# Altium integrated library CDE_Library.IntLib: 6171 symbols (part 16 of 25)
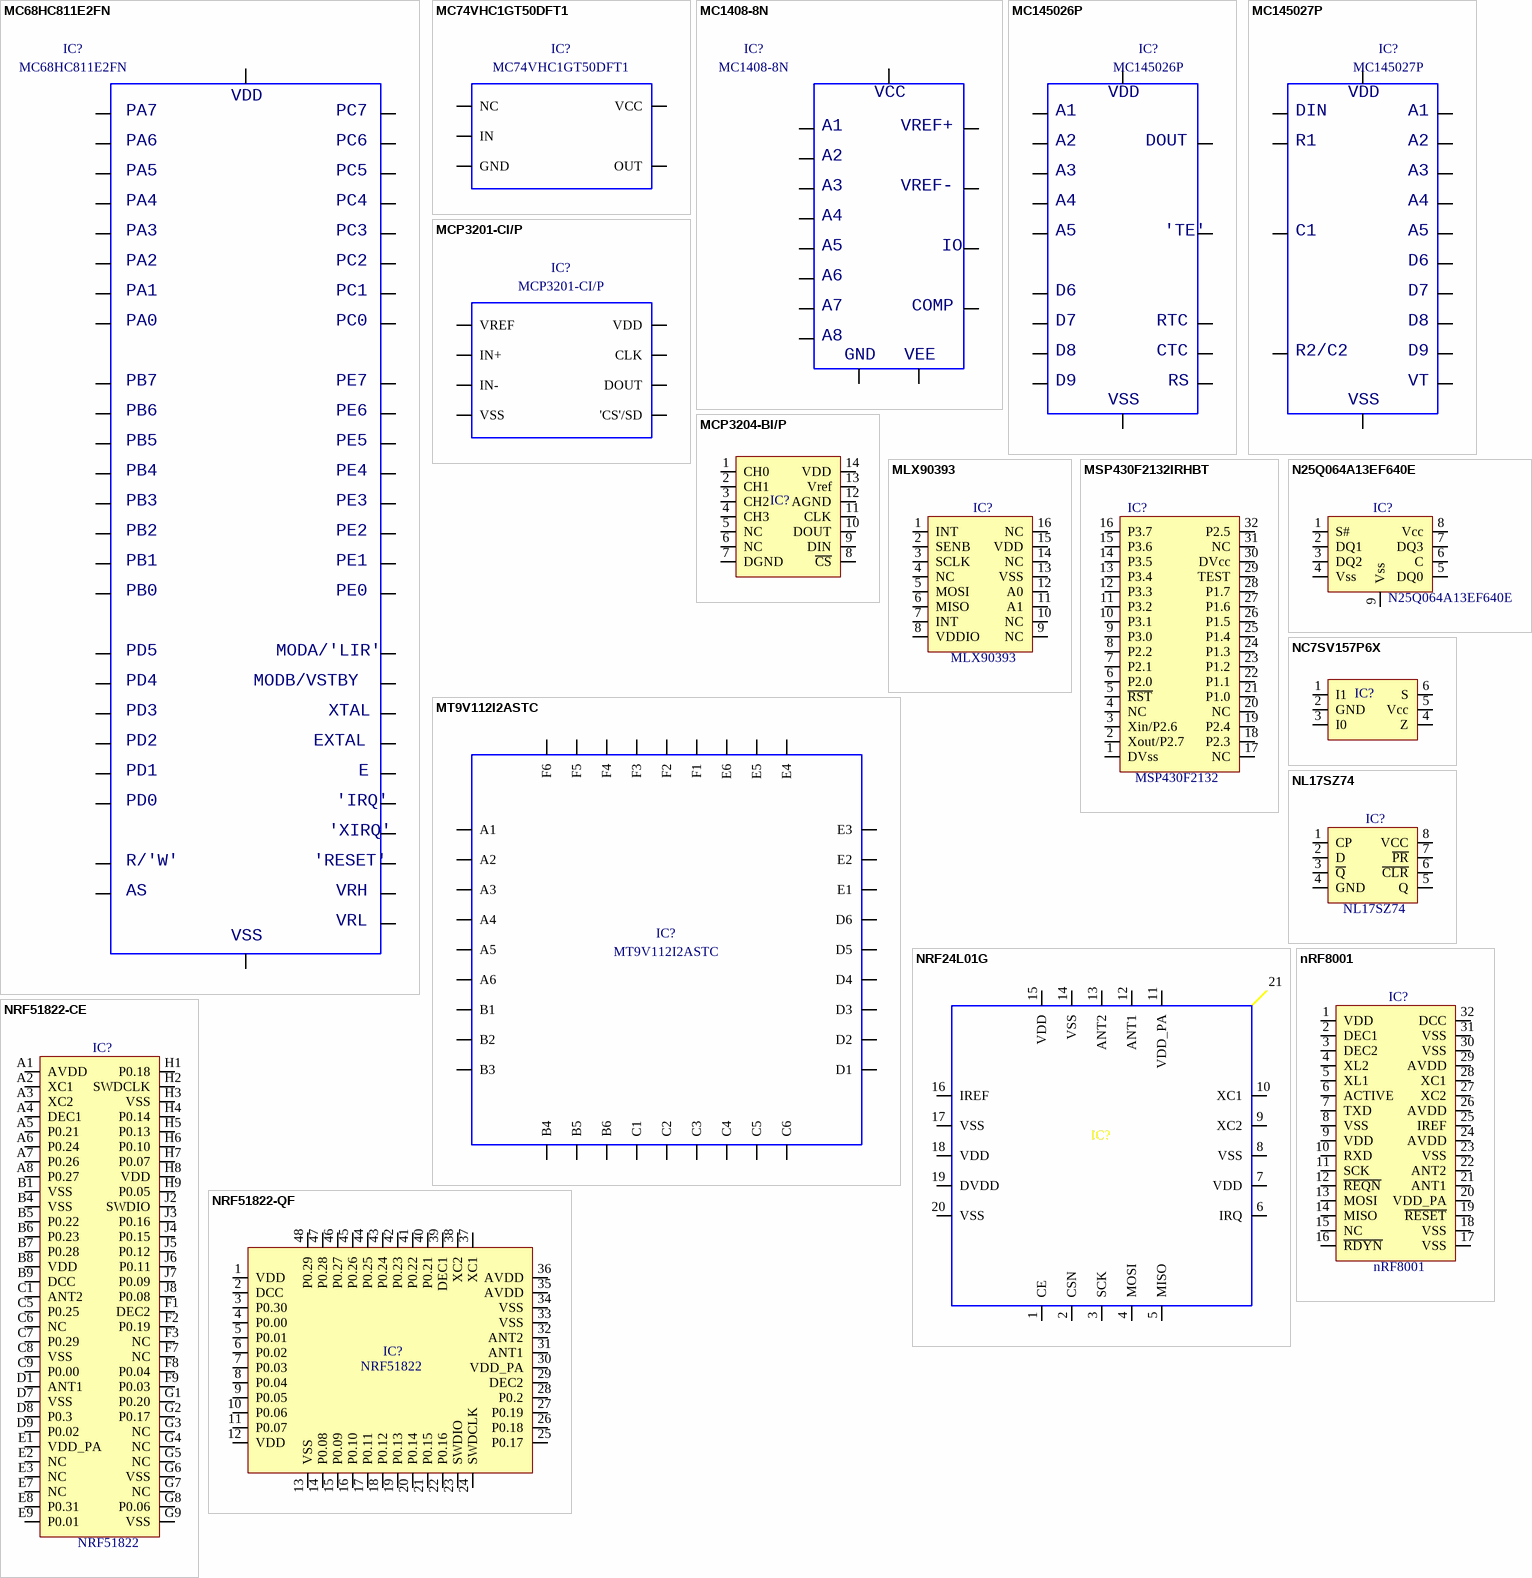
[diagram p272: symbols MC68HC811E2FN to NRF51822-QF]

## nRF8001
designator IC?
Single-chip Bluetooth low-energy solution
footprint smd QFN/32 (5x5mm pitch 0.5)
pins: 1 VDD, 2 DEC1, 3 DEC2, 4 XL2, 5 XL1, 6 ACTIVE, 7 TXD, 8 VSS, 9 VDD, 10 RXD, 11 SCK, 12 ~{REQN}, 13 MOSI, 14 MISO, 15 NC, 16 ~{RDYN}, 17 VSS, 18 VSS, 19 ~{RESET}, 20 VDD_PA, 21 ANT1, 22 ANT2, 23 VSS, 24 AVDD, 25 IREF, 26 AVDD, 27 XC2, 28 XC1, 29 AVDD, 30 VSS, 31 VSS, 32 DCC

## NRF51822-CE
designator IC?, comment NRF51822
Multiprotocol Bluetooth® 4.0 low energy/2.4 GHz RF SoC
footprint smd WLCSP/9x9
pins: A1 AVDD, A2 XC1, A3 XC2, A4 DEC1, A5 P0.21, A6 P0.24, A7 P0.26, A8 P0.27, B1 VSS, B4 VSS, B5 P0.22, B6 P0.23, B7 P0.28, B8 VDD, B9 DCC, C1 ANT2, C5 P0.25, C6 NC, C7 P0.29, C8 VSS, C9 P0.00, D1 ANT1, D7 VSS, D8 P0.3, D9 P0.02, E1 VDD_PA, E2 NC, E3 NC, E7 NC, E8 P0.31, E9 P0.01, F1 DEC2, F2 P0.19, F3 NC, F7 NC, F8 P0.04, F9 P0.03, G1 P0.20, G2 P0.17, G3 NC, G4 NC, G5 NC, G6 VSS, G7 NC, G8 P0.06, G9 VSS, H1 P0.18, H2 SWDCLK, H3 VSS, H4 P0.14, H5 P0.13, H6 P0.10, H7 P0.07, H8 VDD, H9 P0.05, J2 SWDIO, J3 P0.16, J4 P0.15, J5 P0.12, J6 P0.11, J7 P0.09, J8 P0.08

## NRF51822-QF
designator IC?, comment NRF51822
Multiprotocol Bluetooth® 4.0 low energy/2.4 GHz RF SoC
footprint SMD QFN/48 (6X6MM)
pins: 1 VDD, 2 DCC, 3 P0.30, 4 P0.00, 5 P0.01, 6 P0.02, 7 P0.03, 8 P0.04, 9 P0.05, 10 P0.06, 11 P0.07, 12 VDD, 13 VSS, 14 P0.08, 15 P0.09, 16 P0.10, 17 P0.11, 18 P0.12, 19 P0.13, 20 P0.14, 21 P0.15, 22 P0.16, 23 SWDIO, 24 SWDCLK, 25 P0.17, 26 P0.18, 27 P0.19, 28 P0.2, 29 DEC2, 30 VDD_PA, 31 ANT1, 32 ANT2, 33 VSS, 34 VSS, 35 AVDD, 36 AVDD, 37 XC1, 38 XC2, 39 DEC1, 40 P0.21, 41 P0.22, 42 P0.23, 43 P0.24, 44 P0.25, 45 P0.26, 46 P0.27, 47 P0.28, 48 P0.29

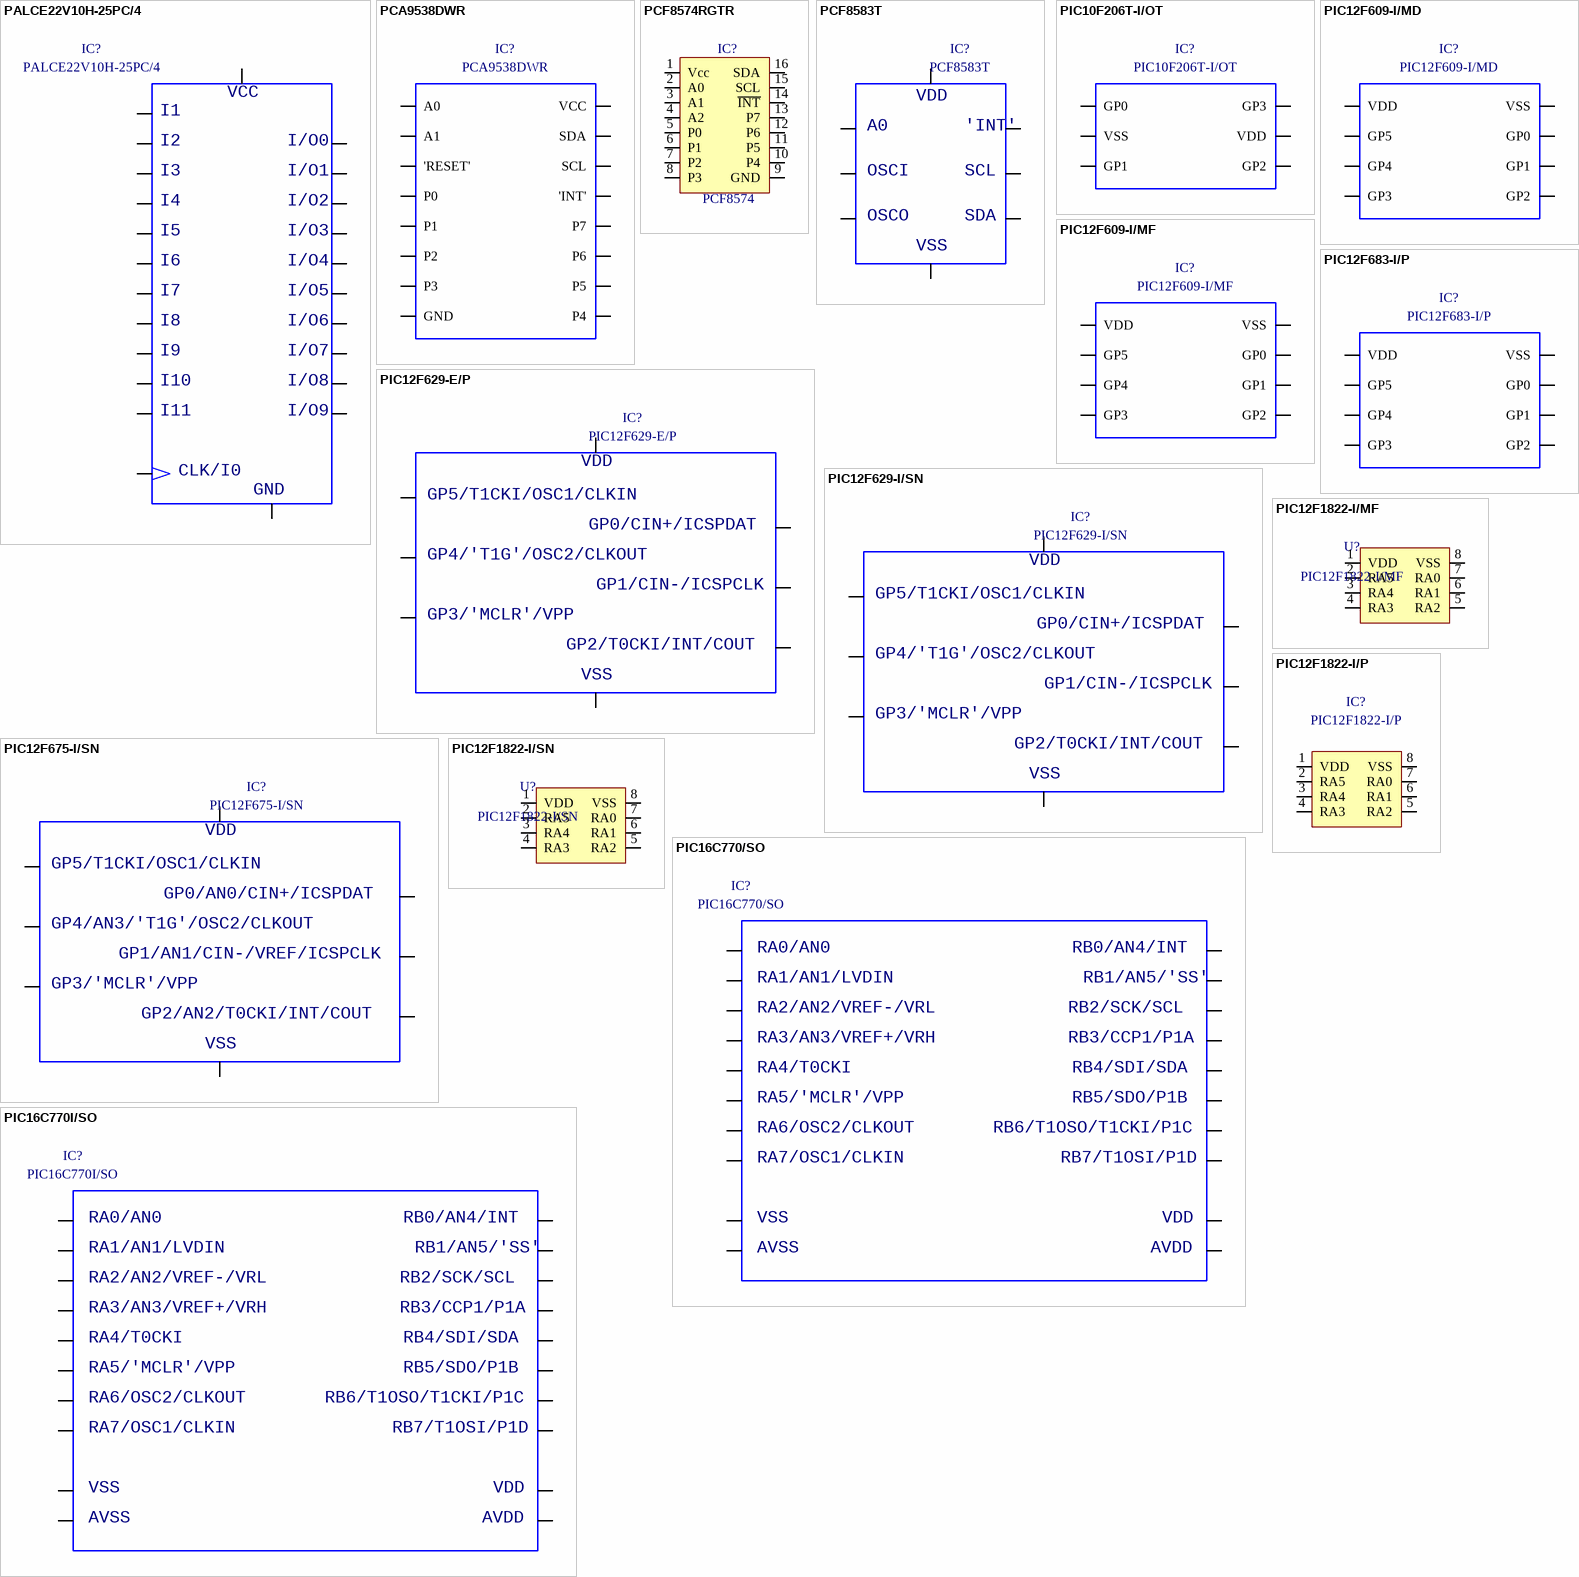
[diagram p155: symbols PALCE22V10H-25PC/4 to PIC16C770I/SO]

## PALCE22V10H-25PC/4
designator IC?
PAL
footprint icv DIP24-300
pins: 1, 2, 3, 4, 5, 6, 7, 8, 9, 10, 11, 12, 13, 14, 15, 16, 17, 18, 19, 20, 21, 22, 23, 24
text: VCC; I1; I2; I/O0; I3; I/O1; I4; I/O2; I5; I/O3; I6; I/O4; I7; I/O5; I8; I/O6; I9; I/O7; I10; I/O8; I11; I/O9; CLK/I0; GND

## PCA9538DWR
designator IC?
remote 8-bit I²C and SMBus low-power I/O expander
footprint smd SOICW/16
pins: 1 A0, 2 A1, 3 'RESET', 4 P0, 5 P1, 6 P2, 7 P3, 8 GND, 9 P4, 10 P5, 11 P6, 12 P7, 13 'INT', 14 SCL, 15 SDA, 16 VCC

## PCF8574RGTR
designator IC?, comment PCF8574
REMOTE 8-BIT I/O EXPANDER FOR I2C BUS
footprint smd QFN/16 (3x3mm p0.5mm)
pins: 1 Vcc, 2 A0, 3 A1, 4 A2, 5 P0, 6 P1, 7 P2, 8 P3, 9 GND, 10 P4, 11 P5, 12 P6, 13 P7, 14 ~{INT}, 15 SCL, 16 SDA

## PCF8583T
designator IC?
clock-calendar wit 240x8-bit RAM
footprint smd SOT176-1 (body 300 pitch 50)
pins: 1, 2, 3, 4, 5, 6, 7, 8
text: VDD; A0; 'INT'; OSCI; SCL; OSCO; SDA; VSS

## PIC10F206T-I/OT
designator IC?
6-Pin, 8-Bit Flash Microcontrollers
footprint smd SOT-23/6p (body 1.6 wide, pitch 0.95mm)
pins: 1 GP0, 2 VSS, 3 GP1, 4 GP2, 5 VDD, 6 GP3

## PIC12F609-I/MD
designator IC?
8-Pin Flash-Based, 8-Bit CMOS Microcontrollers
footprint smd DFN/8 (4x4mm)
pins: 1 VDD, 2 GP5, 3 GP4, 4 GP3, 5 GP2, 6 GP1, 7 GP0, 8 VSS

## PIC12F609-I/MF
designator IC?
8-Pin Flash-Based, 8-Bit CMOS Microcontrollers
footprint smd DFN/8 (3x3mm)
pins: 1 VDD, 2 GP5, 3 GP4, 4 GP3, 5 GP2, 6 GP1, 7 GP0, 8 VSS

## PIC12F629-E/P
designator IC?
8-bit cmos microcontroller unit
footprint icv DIP8-300
pins: 1, 2, 3, 4, 5, 6, 7, 8
text: VDD; GP5/T1CKI/OSC1/CLKIN; GP0/CIN+/ICSPDAT; GP4/'T1G'/OSC2/CLKOUT; GP1/CIN-/ICSPCLK; GP3/'MCLR'/VPP; GP2/T0CKI/INT/COUT; VSS

## PIC12F629-I/SN
designator IC?
8-bit cmos microcontroller unit
footprint smd SOICN/8
pins: 1, 2, 3, 4, 5, 6, 7, 8
text: VDD; GP5/T1CKI/OSC1/CLKIN; GP0/CIN+/ICSPDAT; GP4/'T1G'/OSC2/CLKOUT; GP1/CIN-/ICSPCLK; GP3/'MCLR'/VPP; GP2/T0CKI/INT/COUT; VSS

## PIC12F675-I/SN
designator IC?
8-bit cmos microcontroller unit
footprint smd SOICN/8
pins: 1, 2, 3, 4, 5, 6, 7, 8
text: VDD; GP5/T1CKI/OSC1/CLKIN; GP0/AN0/CIN+/ICSPDAT; GP4/AN3/'T1G'/OSC2/CLKOUT; GP1/AN1/CIN-/VREF/ICSPCLK; GP3/'MCLR'/VPP; GP2/AN2/T0CKI/INT/COUT; VSS

## PIC12F683-I/P
designator IC?
8-bit cmos flash microcontroller unit
footprint icv DIP8-300
pins: 1 VDD, 2 GP5, 3 GP4, 4 GP3, 5 GP2, 6 GP1, 7 GP0, 8 VSS

## PIC12F1822-I/MF
designator U?
8-bit cmos microcontroller unit
footprint smd DFN8
pins: 1 VDD, 2 RA5, 3 RA4, 4 RA3, 5 RA2, 6 RA1, 7 RA0, 8 VSS

## PIC12F1822-I/P
designator IC?
8-bit cmos flash microcontroller unit
footprint icv DIP8-300
pins: 1 VDD, 2 RA5, 3 RA4, 4 RA3, 5 RA2, 6 RA1, 7 RA0, 8 VSS

## PIC12F1822-I/SN
designator U?
8-bit cmos microcontroller unit
footprint smd SOICN/8
pins: 1 VDD, 2 RA5, 3 RA4, 4 RA3, 5 RA2, 6 RA1, 7 RA0, 8 VSS

## PIC16C770/SO
designator IC?
8-bit cmos microcontroller unit
footprint smd SOICW/20
pins: 1, 2, 3, 4, 5, 6, 7, 8, 9, 10, 11, 12, 13, 14, 15, 16, 17, 18, 19, 20
text: RA0/AN0; RB0/AN4/INT; RA1/AN1/LVDIN; RB1/AN5/'SS'; RA2/AN2/VREF-/VRL; RB2/SCK/SCL; RA3/AN3/VREF+/VRH; RB3/CCP1/P1A; RA4/T0CKI; RB4/SDI/SDA; RA5/'MCLR'/VPP; RB5/SDO/P1B; RA6/OSC2/CLKOUT; RB6/T1OSO/T1CKI/P1C; RA7/OSC1/CLKIN; RB7/T1OSI/P1D; VSS; VDD; AVSS; AVDD

## PIC16C770I/SO
designator IC?
8-bit cmos microcontroller unit; Part Number: PIC16C770I/SO; Component Kind: Standard; Component Type: Standard; Designator: PIC16C770I/SO; Footprint: smd SOICW/20; Library Reference: PIC16C770I/SO; Pin Count: 20
footprint smd SOICW/20
pins: 1, 2, 3, 4, 5, 6, 7, 8, 9, 10, 11, 12, 13, 14, 15, 16, 17, 18, 19, 20
text: RA0/AN0; RB0/AN4/INT; RA1/AN1/LVDIN; RB1/AN5/'SS'; RA2/AN2/VREF-/VRL; RB2/SCK/SCL; RA3/AN3/VREF+/VRH; RB3/CCP1/P1A; RA4/T0CKI; RB4/SDI/SDA; RA5/'MCLR'/VPP; RB5/SDO/P1B; RA6/OSC2/CLKOUT; RB6/T1OSO/T1CKI/P1C; RA7/OSC1/CLKIN; RB7/T1OSI/P1D; VSS; VDD; AVSS; AVDD

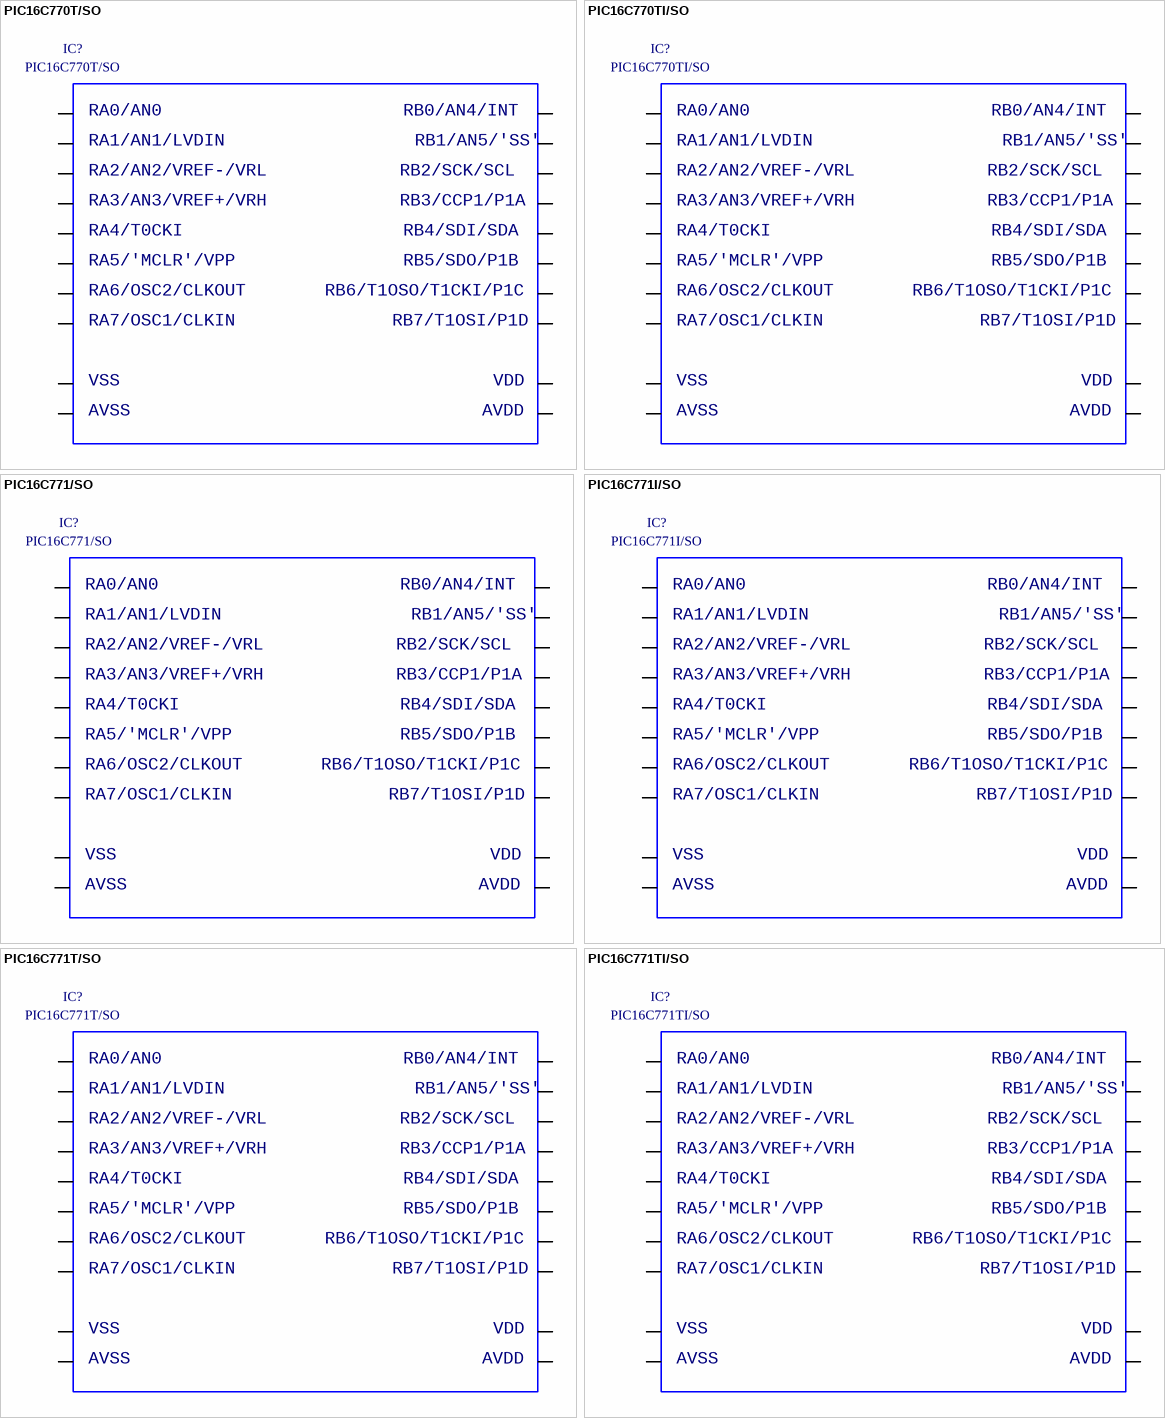
[diagram p156: symbols PIC16C770T/SO to PIC16C771TI/SO]

## PIC16C770T/SO
designator IC?
8-bit cmos microcontroller unit; Part Number: PIC16C770T/SO; Component Kind: Standard; Component Type: Standard; Designator: PIC16C770T/SO; Footprint: smd SOICW/20; Library Reference: PIC16C770T/SO; Pin Count: 20
footprint smd SOICW/20
pins: 1, 2, 3, 4, 5, 6, 7, 8, 9, 10, 11, 12, 13, 14, 15, 16, 17, 18, 19, 20
text: RA0/AN0; RB0/AN4/INT; RA1/AN1/LVDIN; RB1/AN5/'SS'; RA2/AN2/VREF-/VRL; RB2/SCK/SCL; RA3/AN3/VREF+/VRH; RB3/CCP1/P1A; RA4/T0CKI; RB4/SDI/SDA; RA5/'MCLR'/VPP; RB5/SDO/P1B; RA6/OSC2/CLKOUT; RB6/T1OSO/T1CKI/P1C; RA7/OSC1/CLKIN; RB7/T1OSI/P1D; VSS; VDD; AVSS; AVDD

## PIC16C770TI/SO
designator IC?
8-bit cmos microcontroller unit; Part Number: PIC16C770TI/SO; Component Kind: Standard; Component Type: Standard; Designator: PIC16C770TI/SO; Footprint: smd SOICW/20; Library Reference: PIC16C770TI/SO; Pin Count: 20
footprint smd SOICW/20
pins: 1, 2, 3, 4, 5, 6, 7, 8, 9, 10, 11, 12, 13, 14, 15, 16, 17, 18, 19, 20
text: RA0/AN0; RB0/AN4/INT; RA1/AN1/LVDIN; RB1/AN5/'SS'; RA2/AN2/VREF-/VRL; RB2/SCK/SCL; RA3/AN3/VREF+/VRH; RB3/CCP1/P1A; RA4/T0CKI; RB4/SDI/SDA; RA5/'MCLR'/VPP; RB5/SDO/P1B; RA6/OSC2/CLKOUT; RB6/T1OSO/T1CKI/P1C; RA7/OSC1/CLKIN; RB7/T1OSI/P1D; VSS; VDD; AVSS; AVDD

## PIC16C771/SO
designator IC?
8-bit cmos microcontroller unit; Part Number: PIC16C771/SO; Component Kind: Standard; Component Type: Standard; Designator: PIC16C771/SO; Footprint: smd SOICW/20; Library Reference: PIC16C771/SO; Pin Count: 20
footprint smd SOICW/20
pins: 1, 2, 3, 4, 5, 6, 7, 8, 9, 10, 11, 12, 13, 14, 15, 16, 17, 18, 19, 20
text: RA0/AN0; RB0/AN4/INT; RA1/AN1/LVDIN; RB1/AN5/'SS'; RA2/AN2/VREF-/VRL; RB2/SCK/SCL; RA3/AN3/VREF+/VRH; RB3/CCP1/P1A; RA4/T0CKI; RB4/SDI/SDA; RA5/'MCLR'/VPP; RB5/SDO/P1B; RA6/OSC2/CLKOUT; RB6/T1OSO/T1CKI/P1C; RA7/OSC1/CLKIN; RB7/T1OSI/P1D; VSS; VDD; AVSS; AVDD

## PIC16C771I/SO
designator IC?
8-bit cmos microcontroller unit; Part Number: PIC16C771I/SO; Component Kind: Standard; Component Type: Standard; Designator: PIC16C771I/SO; Footprint: smd SOICW/20; Library Reference: PIC16C771I/SO; Pin Count: 20
footprint smd SOICW/20
pins: 1, 2, 3, 4, 5, 6, 7, 8, 9, 10, 11, 12, 13, 14, 15, 16, 17, 18, 19, 20
text: RA0/AN0; RB0/AN4/INT; RA1/AN1/LVDIN; RB1/AN5/'SS'; RA2/AN2/VREF-/VRL; RB2/SCK/SCL; RA3/AN3/VREF+/VRH; RB3/CCP1/P1A; RA4/T0CKI; RB4/SDI/SDA; RA5/'MCLR'/VPP; RB5/SDO/P1B; RA6/OSC2/CLKOUT; RB6/T1OSO/T1CKI/P1C; RA7/OSC1/CLKIN; RB7/T1OSI/P1D; VSS; VDD; AVSS; AVDD

## PIC16C771T/SO
designator IC?
8-bit cmos microcontroller unit; Part Number: PIC16C771T/SO; Component Kind: Standard; Component Type: Standard; Designator: PIC16C771T/SO; Footprint: smd SOICW/20; Library Reference: PIC16C771T/SO; Pin Count: 20
footprint smd SOICW/20
pins: 1, 2, 3, 4, 5, 6, 7, 8, 9, 10, 11, 12, 13, 14, 15, 16, 17, 18, 19, 20
text: RA0/AN0; RB0/AN4/INT; RA1/AN1/LVDIN; RB1/AN5/'SS'; RA2/AN2/VREF-/VRL; RB2/SCK/SCL; RA3/AN3/VREF+/VRH; RB3/CCP1/P1A; RA4/T0CKI; RB4/SDI/SDA; RA5/'MCLR'/VPP; RB5/SDO/P1B; RA6/OSC2/CLKOUT; RB6/T1OSO/T1CKI/P1C; RA7/OSC1/CLKIN; RB7/T1OSI/P1D; VSS; VDD; AVSS; AVDD

## PIC16C771TI/SO
designator IC?
8-bit cmos microcontroller unit; Part Number: PIC16C771TI/SO; Component Kind: Standard; Component Type: Standard; Designator: PIC16C771TI/SO; Footprint: smd SOICW/20; Library Reference: PIC16C771TI/SO; Pin Count: 20
footprint smd SOICW/20
pins: 1, 2, 3, 4, 5, 6, 7, 8, 9, 10, 11, 12, 13, 14, 15, 16, 17, 18, 19, 20
text: RA0/AN0; RB0/AN4/INT; RA1/AN1/LVDIN; RB1/AN5/'SS'; RA2/AN2/VREF-/VRL; RB2/SCK/SCL; RA3/AN3/VREF+/VRH; RB3/CCP1/P1A; RA4/T0CKI; RB4/SDI/SDA; RA5/'MCLR'/VPP; RB5/SDO/P1B; RA6/OSC2/CLKOUT; RB6/T1OSO/T1CKI/P1C; RA7/OSC1/CLKIN; RB7/T1OSI/P1D; VSS; VDD; AVSS; AVDD

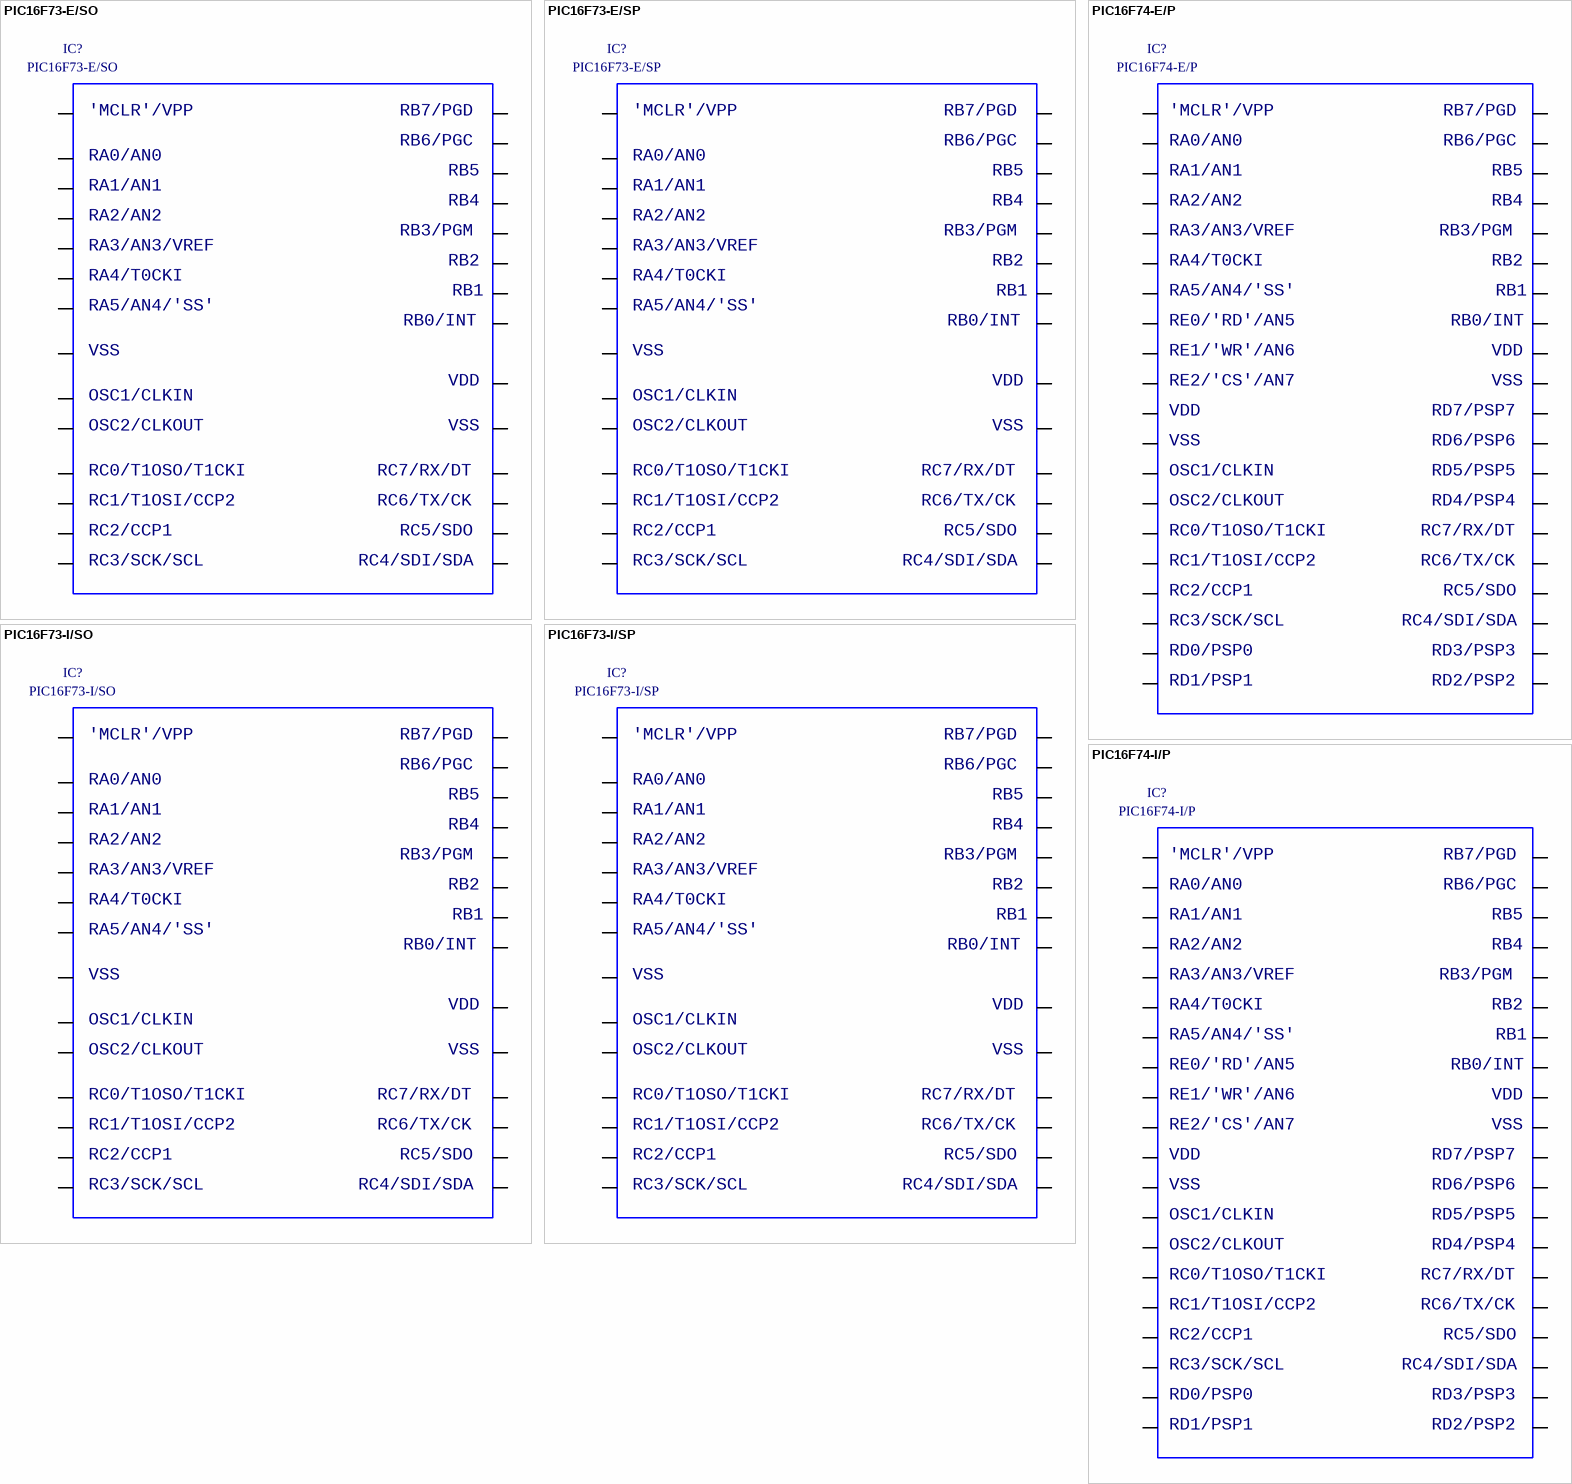
[diagram p157: symbols PIC16F73-E/SO to PIC16F74-I/P]

## PIC16F73-E/SO
designator IC?
8-bit cmos flash microcontroller unit; Part Number: PIC16F73-E/SO; Component Kind: Standard; Component Type: Standard; Designator: PIC16F73-E/SO; Footprint: smd SOICW/28; Library Reference: PIC16F73-E/SO; Pin Count: 28
footprint smd SOICW/28
pins: 1, 2, 3, 4, 5, 6, 7, 8, 9, 10, 11, 12, 13, 14, 15, 16, 17, 18, 19, 20, 21, 22, 23, 24, 25, 26, 27, 28
text: 'MCLR'/VPP; RB7/PGD; RB6/PGC; RA0/AN0; RB5; RA1/AN1; RB4; RA2/AN2; RB3/PGM; RA3/AN3/VREF; RB2; RA4/T0CKI; RB1; RA5/AN4/'SS'; RB0/INT; VSS; VDD; OSC1/CLKIN; OSC2/CLKOUT; RC0/T1OSO/T1CKI; RC7/RX/DT; RC1/T1OSI/CCP2; RC6/TX/CK; RC2/CCP1; RC5/SDO; RC3/SCK/SCL; RC4/SDI/SDA

## PIC16F73-E/SP
designator IC?
8-bit cmos flash microcontroller unit; Part Number: PIC16F73-E/SP; Component Kind: Standard; Component Type: Standard; Designator: PIC16F73-E/SP; Footprint: icv DIP28-300; Library Reference: PIC16F73-E/SP; Pin Count: 28
footprint icv DIP28-300
pins: 1, 2, 3, 4, 5, 6, 7, 8, 9, 10, 11, 12, 13, 14, 15, 16, 17, 18, 19, 20, 21, 22, 23, 24, 25, 26, 27, 28
text: 'MCLR'/VPP; RB7/PGD; RB6/PGC; RA0/AN0; RB5; RA1/AN1; RB4; RA2/AN2; RB3/PGM; RA3/AN3/VREF; RB2; RA4/T0CKI; RB1; RA5/AN4/'SS'; RB0/INT; VSS; VDD; OSC1/CLKIN; OSC2/CLKOUT; RC0/T1OSO/T1CKI; RC7/RX/DT; RC1/T1OSI/CCP2; RC6/TX/CK; RC2/CCP1; RC5/SDO; RC3/SCK/SCL; RC4/SDI/SDA

## PIC16F73-I/SO
designator IC?
8-bit cmos flash microcontroller unit
footprint smd SOICW/28
pins: 1, 2, 3, 4, 5, 6, 7, 8, 9, 10, 11, 12, 13, 14, 15, 16, 17, 18, 19, 20, 21, 22, 23, 24, 25, 26, 27, 28
text: 'MCLR'/VPP; RB7/PGD; RB6/PGC; RA0/AN0; RB5; RA1/AN1; RB4; RA2/AN2; RB3/PGM; RA3/AN3/VREF; RB2; RA4/T0CKI; RB1; RA5/AN4/'SS'; RB0/INT; VSS; VDD; OSC1/CLKIN; OSC2/CLKOUT; RC0/T1OSO/T1CKI; RC7/RX/DT; RC1/T1OSI/CCP2; RC6/TX/CK; RC2/CCP1; RC5/SDO; RC3/SCK/SCL; RC4/SDI/SDA

## PIC16F73-I/SP
designator IC?
8-bit cmos flash microcontroller unit
footprint icv DIP28-300
pins: 1, 2, 3, 4, 5, 6, 7, 8, 9, 10, 11, 12, 13, 14, 15, 16, 17, 18, 19, 20, 21, 22, 23, 24, 25, 26, 27, 28
text: 'MCLR'/VPP; RB7/PGD; RB6/PGC; RA0/AN0; RB5; RA1/AN1; RB4; RA2/AN2; RB3/PGM; RA3/AN3/VREF; RB2; RA4/T0CKI; RB1; RA5/AN4/'SS'; RB0/INT; VSS; VDD; OSC1/CLKIN; OSC2/CLKOUT; RC0/T1OSO/T1CKI; RC7/RX/DT; RC1/T1OSI/CCP2; RC6/TX/CK; RC2/CCP1; RC5/SDO; RC3/SCK/SCL; RC4/SDI/SDA

## PIC16F74-E/P
designator IC?
8-bit cmos flash microcontroller unit; Part Number: PIC16F74-E/P; Component Kind: Standard; Component Type: Standard; Designator: PIC16F74-E/P; Footprint: icv DIP40-600; Library Reference: PIC16F74-E/P; Pin Count: 40
footprint icv DIP40-600
pins: 1, 2, 3, 4, 5, 6, 7, 8, 9, 10, 11, 12, 13, 14, 15, 16, 17, 18, 19, 20, 21, 22, 23, 24, 25, 26, 27, 28, 29, 30, 31, 32, 33, 34, 35, 36, 37, 38, 39, 40
text: 'MCLR'/VPP; RB7/PGD; RA0/AN0; RB6/PGC; RA1/AN1; RB5; RA2/AN2; RB4; RA3/AN3/VREF; RB3/PGM; RA4/T0CKI; RB2; RA5/AN4/'SS'; RB1; RE0/'RD'/AN5; RB0/INT; RE1/'WR'/AN6; VDD; RE2/'CS'/AN7; VSS; RD7/PSP7; RD6/PSP6; OSC1/CLKIN; RD5/PSP5; OSC2/CLKOUT; RD4/PSP4; RC0/T1OSO/T1CKI; RC7/RX/DT; RC1/T1OSI/CCP2; RC6/TX/CK; RC2/CCP1; RC5/SDO; RC3/SCK/SCL; RC4/SDI/SDA; RD0/PSP0; RD3/PSP3; RD1/PSP1; RD2/PSP2

## PIC16F74-I/P
designator IC?
8-bit cmos flash microcontroller unit
footprint icv DIP40-600
pins: 1, 2, 3, 4, 5, 6, 7, 8, 9, 10, 11, 12, 13, 14, 15, 16, 17, 18, 19, 20, 21, 22, 23, 24, 25, 26, 27, 28, 29, 30, 31, 32, 33, 34, 35, 36, 37, 38, 39, 40
text: 'MCLR'/VPP; RB7/PGD; RA0/AN0; RB6/PGC; RA1/AN1; RB5; RA2/AN2; RB4; RA3/AN3/VREF; RB3/PGM; RA4/T0CKI; RB2; RA5/AN4/'SS'; RB1; RE0/'RD'/AN5; RB0/INT; RE1/'WR'/AN6; VDD; RE2/'CS'/AN7; VSS; RD7/PSP7; RD6/PSP6; OSC1/CLKIN; RD5/PSP5; OSC2/CLKOUT; RD4/PSP4; RC0/T1OSO/T1CKI; RC7/RX/DT; RC1/T1OSI/CCP2; RC6/TX/CK; RC2/CCP1; RC5/SDO; RC3/SCK/SCL; RC4/SDI/SDA; RD0/PSP0; RD3/PSP3; RD1/PSP1; RD2/PSP2

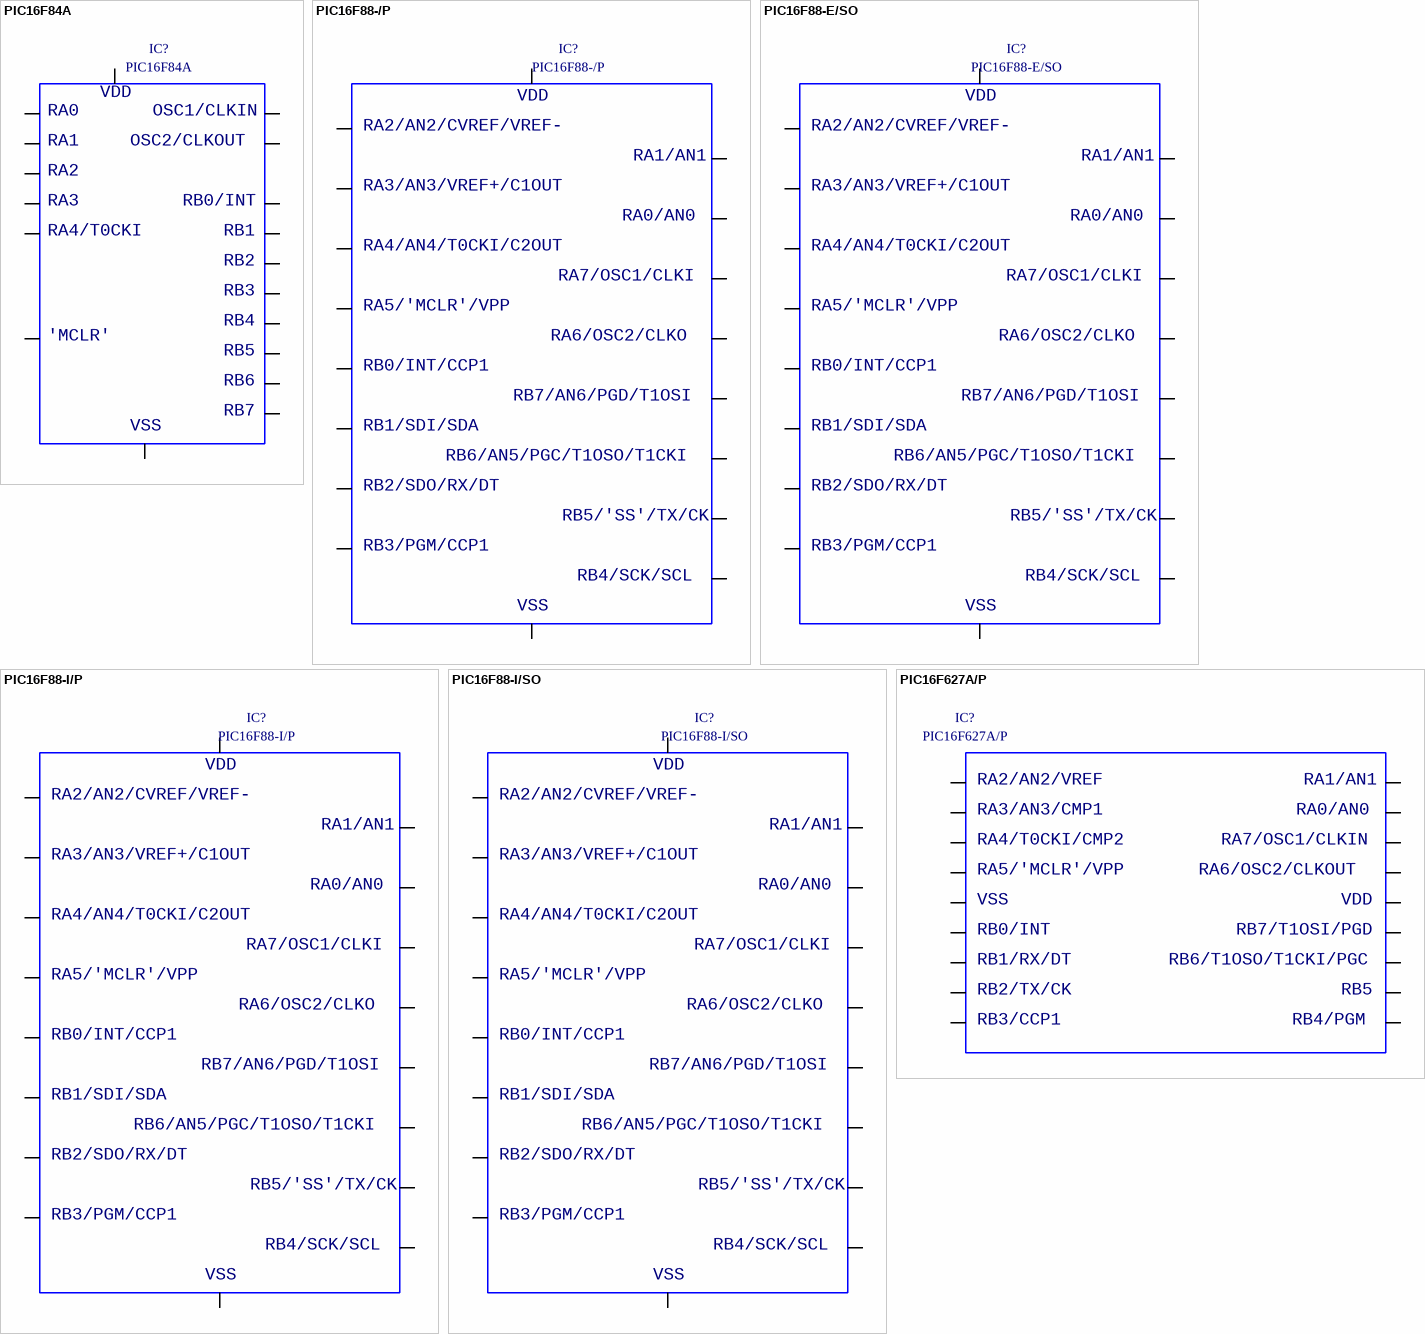
[diagram p158: symbols PIC16F84A to PIC16F627A/P]

## PIC16F84A
designator IC?
8-bit microcontroller unit
footprint icv DIP18-300
pins: 1, 2, 3, 4, 5, 6, 7, 8, 9, 10, 11, 12, 13, 14, 15, 16, 17, 18
text: VDD; RA0; OSC1/CLKIN; RA1; OSC2/CLKOUT; RA2; RA3; RB0/INT; RA4/T0CKI; RB1; RB2; RB3; RB4; 'MCLR'; RB5; RB6; RB7; VSS

## PIC16F88-/P
designator IC?
flash microcontroller unit
footprint icv DIP18-300
pins: 1, 2, 3, 4, 5, 6, 7, 8, 9, 10, 11, 12, 13, 14, 15, 16, 17, 18
text: VDD; RA2/AN2/CVREF/VREF-; RA1/AN1; RA3/AN3/VREF+/C1OUT; RA0/AN0; RA4/AN4/T0CKI/C2OUT; RA7/OSC1/CLKI; RA5/'MCLR'/VPP; RA6/OSC2/CLKO; RB0/INT/CCP1; RB7/AN6/PGD/T1OSI; RB1/SDI/SDA; RB6/AN5/PGC/T1OSO/T1CKI; RB2/SDO/RX/DT; RB5/'SS'/TX/CK; RB3/PGM/CCP1; RB4/SCK/SCL; VSS

## PIC16F88-E/SO
designator IC?
flash microcontroller unit; Part Number: PIC16F88-E/SO; Component Kind: Standard; Component Type: Standard; Designator: PIC16F88-E/SO; Footprint: smd SOICW/18; Library Reference: PIC16F88-E/SO; Pin Count: 18
footprint smd SOICW/18
pins: 1, 2, 3, 4, 5, 6, 7, 8, 9, 10, 11, 12, 13, 14, 15, 16, 17, 18
text: VDD; RA2/AN2/CVREF/VREF-; RA1/AN1; RA3/AN3/VREF+/C1OUT; RA0/AN0; RA4/AN4/T0CKI/C2OUT; RA7/OSC1/CLKI; RA5/'MCLR'/VPP; RA6/OSC2/CLKO; RB0/INT/CCP1; RB7/AN6/PGD/T1OSI; RB1/SDI/SDA; RB6/AN5/PGC/T1OSO/T1CKI; RB2/SDO/RX/DT; RB5/'SS'/TX/CK; RB3/PGM/CCP1; RB4/SCK/SCL; VSS

## PIC16F88-I/P
designator IC?
flash microcontroller unit; Part Number: PIC16F88-I/P; Component Kind: Standard; Component Type: Standard; Designator: PIC16F88-I/P; Footprint: icv DIP18-300; Library Reference: PIC16F88-I/P; Pin Count: 18
footprint icv DIP18-300
pins: 1, 2, 3, 4, 5, 6, 7, 8, 9, 10, 11, 12, 13, 14, 15, 16, 17, 18
text: VDD; RA2/AN2/CVREF/VREF-; RA1/AN1; RA3/AN3/VREF+/C1OUT; RA0/AN0; RA4/AN4/T0CKI/C2OUT; RA7/OSC1/CLKI; RA5/'MCLR'/VPP; RA6/OSC2/CLKO; RB0/INT/CCP1; RB7/AN6/PGD/T1OSI; RB1/SDI/SDA; RB6/AN5/PGC/T1OSO/T1CKI; RB2/SDO/RX/DT; RB5/'SS'/TX/CK; RB3/PGM/CCP1; RB4/SCK/SCL; VSS

## PIC16F88-I/SO
designator IC?
flash microcontroller unit
footprint smd SOICW/18
pins: 1, 2, 3, 4, 5, 6, 7, 8, 9, 10, 11, 12, 13, 14, 15, 16, 17, 18
text: VDD; RA2/AN2/CVREF/VREF-; RA1/AN1; RA3/AN3/VREF+/C1OUT; RA0/AN0; RA4/AN4/T0CKI/C2OUT; RA7/OSC1/CLKI; RA5/'MCLR'/VPP; RA6/OSC2/CLKO; RB0/INT/CCP1; RB7/AN6/PGD/T1OSI; RB1/SDI/SDA; RB6/AN5/PGC/T1OSO/T1CKI; RB2/SDO/RX/DT; RB5/'SS'/TX/CK; RB3/PGM/CCP1; RB4/SCK/SCL; VSS

## PIC16F627A/P
designator IC?
8-bit cmos flash microcontroller unit
footprint icv DIP18-300
pins: 1, 2, 3, 4, 5, 6, 7, 8, 9, 10, 11, 12, 13, 14, 15, 16, 17, 18
text: RA2/AN2/VREF; RA1/AN1; RA3/AN3/CMP1; RA0/AN0; RA4/T0CKI/CMP2; RA7/OSC1/CLKIN; RA5/'MCLR'/VPP; RA6/OSC2/CLKOUT; VSS; VDD; RB0/INT; RB7/T1OSI/PGD; RB1/RX/DT; RB6/T1OSO/T1CKI/PGC; RB2/TX/CK; RB5; RB3/CCP1; RB4/PGM

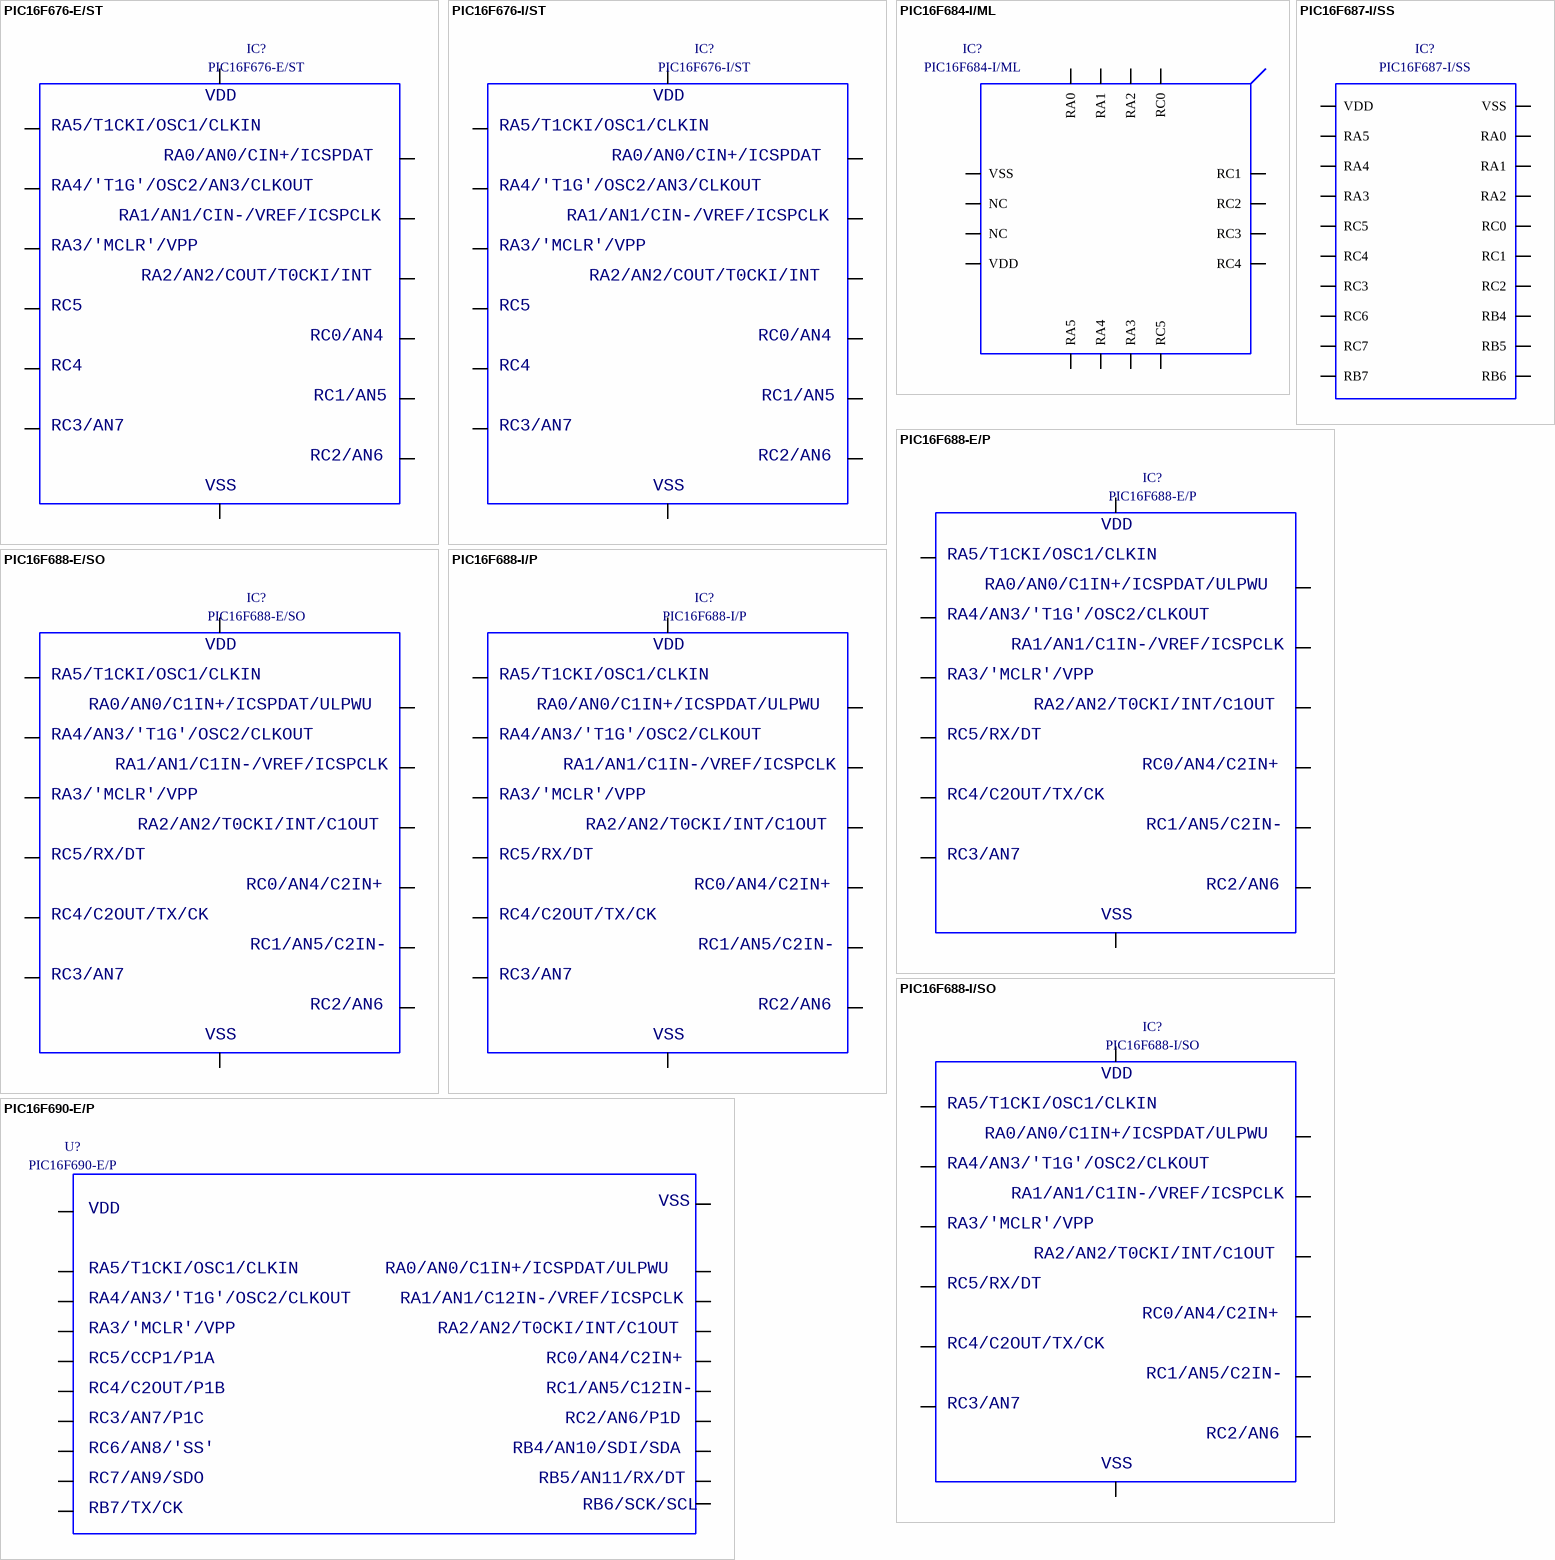
[diagram p159: symbols PIC16F676-E/ST to PIC16F690-E/P]

## PIC16F676-E/ST
designator IC?
8-bit cmos flash microcontroller unit; Part Number: PIC16F676-E/ST; Component Kind: Standard; Component Type: Standard; Designator: PIC16F676-E/ST; Footprint: smd TSSOP/14 (body 4.4 pitch 0.65); Library Reference: PIC16F676-E/ST; Pin Count: 14
footprint smd TSSOP/14 (body 4.4 pitch 0.65)
pins: 1, 2, 3, 4, 5, 6, 7, 8, 9, 10, 11, 12, 13, 14
text: VDD; RA5/T1CKI/OSC1/CLKIN; RA0/AN0/CIN+/ICSPDAT; RA4/'T1G'/OSC2/AN3/CLKOUT; RA1/AN1/CIN-/VREF/ICSPCLK; RA3/'MCLR'/VPP; RA2/AN2/COUT/T0CKI/INT; RC5; RC0/AN4; RC4; RC1/AN5; RC3/AN7; RC2/AN6; VSS

## PIC16F676-I/ST
designator IC?
8-bit cmos flash microcontroller unit
footprint smd TSSOP/14 (body 4.4 pitch 0.65)
pins: 1, 2, 3, 4, 5, 6, 7, 8, 9, 10, 11, 12, 13, 14
text: VDD; RA5/T1CKI/OSC1/CLKIN; RA0/AN0/CIN+/ICSPDAT; RA4/'T1G'/OSC2/AN3/CLKOUT; RA1/AN1/CIN-/VREF/ICSPCLK; RA3/'MCLR'/VPP; RA2/AN2/COUT/T0CKI/INT; RC5; RC0/AN4; RC4; RC1/AN5; RC3/AN7; RC2/AN6; VSS

## PIC16F684-I/ML
designator IC?
8-bit flash-based cmos microcontroller unit
footprint smd QFN/16 (4x4x0.75mm p0.65mm)
pins: 1 RA5, 2 RA4, 3 RA3, 4 RC5, 5 RC4, 6 RC3, 7 RC2, 8 RC1, 9 RC0, 10 RA2, 11 RA1, 12 RA0, 13 VSS, 14 NC, 15 NC, 16 VDD, 17

## PIC16F687-I/SS
designator IC?
8-bit cmos flash microcontroller unit
footprint smd SSOP/20 (body 5.3 pitch 0.65)
pins: 1 VDD, 2 RA5, 3 RA4, 4 RA3, 5 RC5, 6 RC4, 7 RC3, 8 RC6, 9 RC7, 10 RB7, 11 RB6, 12 RB5, 13 RB4, 14 RC2, 15 RC1, 16 RC0, 17 RA2, 18 RA1, 19 RA0, 20 VSS

## PIC16F688-E/P
designator IC?
8-bit cmos flash microcontroller unit; Part Number: PIC16F688-E/P; Component Kind: Standard; Component Type: Standard; Designator: PIC16F688-E/P; Footprint: icv DIP14-300; Library Reference: PIC16F688-E/P; Pin Count: 14
footprint icv DIP14-300
pins: 1, 2, 3, 4, 5, 6, 7, 8, 9, 10, 11, 12, 13, 14
text: VDD; RA5/T1CKI/OSC1/CLKIN; RA0/AN0/C1IN+/ICSPDAT/ULPWU; RA4/AN3/'T1G'/OSC2/CLKOUT; RA1/AN1/C1IN-/VREF/ICSPCLK; RA3/'MCLR'/VPP; RA2/AN2/T0CKI/INT/C1OUT; RC5/RX/DT; RC0/AN4/C2IN+; RC4/C2OUT/TX/CK; RC1/AN5/C2IN-; RC3/AN7; RC2/AN6; VSS

## PIC16F688-E/SO
designator IC?
8-bit cmos flash microcontroller unit; Part Number: PIC16F688-E/SO; Component Kind: Standard; Component Type: Standard; Designator: PIC16F688-E/SO; Footprint: smd SOICN/14; Library Reference: PIC16F688-E/SO; Pin Count: 14
footprint smd SOICN/14
pins: 1, 2, 3, 4, 5, 6, 7, 8, 9, 10, 11, 12, 13, 14
text: VDD; RA5/T1CKI/OSC1/CLKIN; RA0/AN0/C1IN+/ICSPDAT/ULPWU; RA4/AN3/'T1G'/OSC2/CLKOUT; RA1/AN1/C1IN-/VREF/ICSPCLK; RA3/'MCLR'/VPP; RA2/AN2/T0CKI/INT/C1OUT; RC5/RX/DT; RC0/AN4/C2IN+; RC4/C2OUT/TX/CK; RC1/AN5/C2IN-; RC3/AN7; RC2/AN6; VSS

## PIC16F688-I/P
designator IC?
8-bit cmos flash microcontroller unit
footprint icv DIP14-300
pins: 1, 2, 3, 4, 5, 6, 7, 8, 9, 10, 11, 12, 13, 14
text: VDD; RA5/T1CKI/OSC1/CLKIN; RA0/AN0/C1IN+/ICSPDAT/ULPWU; RA4/AN3/'T1G'/OSC2/CLKOUT; RA1/AN1/C1IN-/VREF/ICSPCLK; RA3/'MCLR'/VPP; RA2/AN2/T0CKI/INT/C1OUT; RC5/RX/DT; RC0/AN4/C2IN+; RC4/C2OUT/TX/CK; RC1/AN5/C2IN-; RC3/AN7; RC2/AN6; VSS

## PIC16F688-I/SO
designator IC?
8-bit cmos flash microcontroller unit
footprint smd SOICN/14
pins: 1, 2, 3, 4, 5, 6, 7, 8, 9, 10, 11, 12, 13, 14
text: VDD; RA5/T1CKI/OSC1/CLKIN; RA0/AN0/C1IN+/ICSPDAT/ULPWU; RA4/AN3/'T1G'/OSC2/CLKOUT; RA1/AN1/C1IN-/VREF/ICSPCLK; RA3/'MCLR'/VPP; RA2/AN2/T0CKI/INT/C1OUT; RC5/RX/DT; RC0/AN4/C2IN+; RC4/C2OUT/TX/CK; RC1/AN5/C2IN-; RC3/AN7; RC2/AN6; VSS

## PIC16F690-E/P
designator U?
8-bit cmos flash microcontroller unit
footprint icv DIP20-300
pins: 1, 2, 3, 4, 5, 6, 7, 8, 9, 10, 11, 12, 13, 14, 15, 16, 17, 18, 19, 20
text: VSS; VDD; RA5/T1CKI/OSC1/CLKIN; RA0/AN0/C1IN+/ICSPDAT/ULPWU; RA4/AN3/'T1G'/OSC2/CLKOUT; RA1/AN1/C12IN-/VREF/ICSPCLK; RA3/'MCLR'/VPP; RA2/AN2/T0CKI/INT/C1OUT; RC5/CCP1/P1A; RC0/AN4/C2IN+; RC4/C2OUT/P1B; RC1/AN5/C12IN-; RC3/AN7/P1C; RC2/AN6/P1D; RC6/AN8/'SS'; RB4/AN10/SDI/SDA; RC7/AN9/SDO; RB5/AN11/RX/DT; RB6/SCK/SCL; RB7/TX/CK

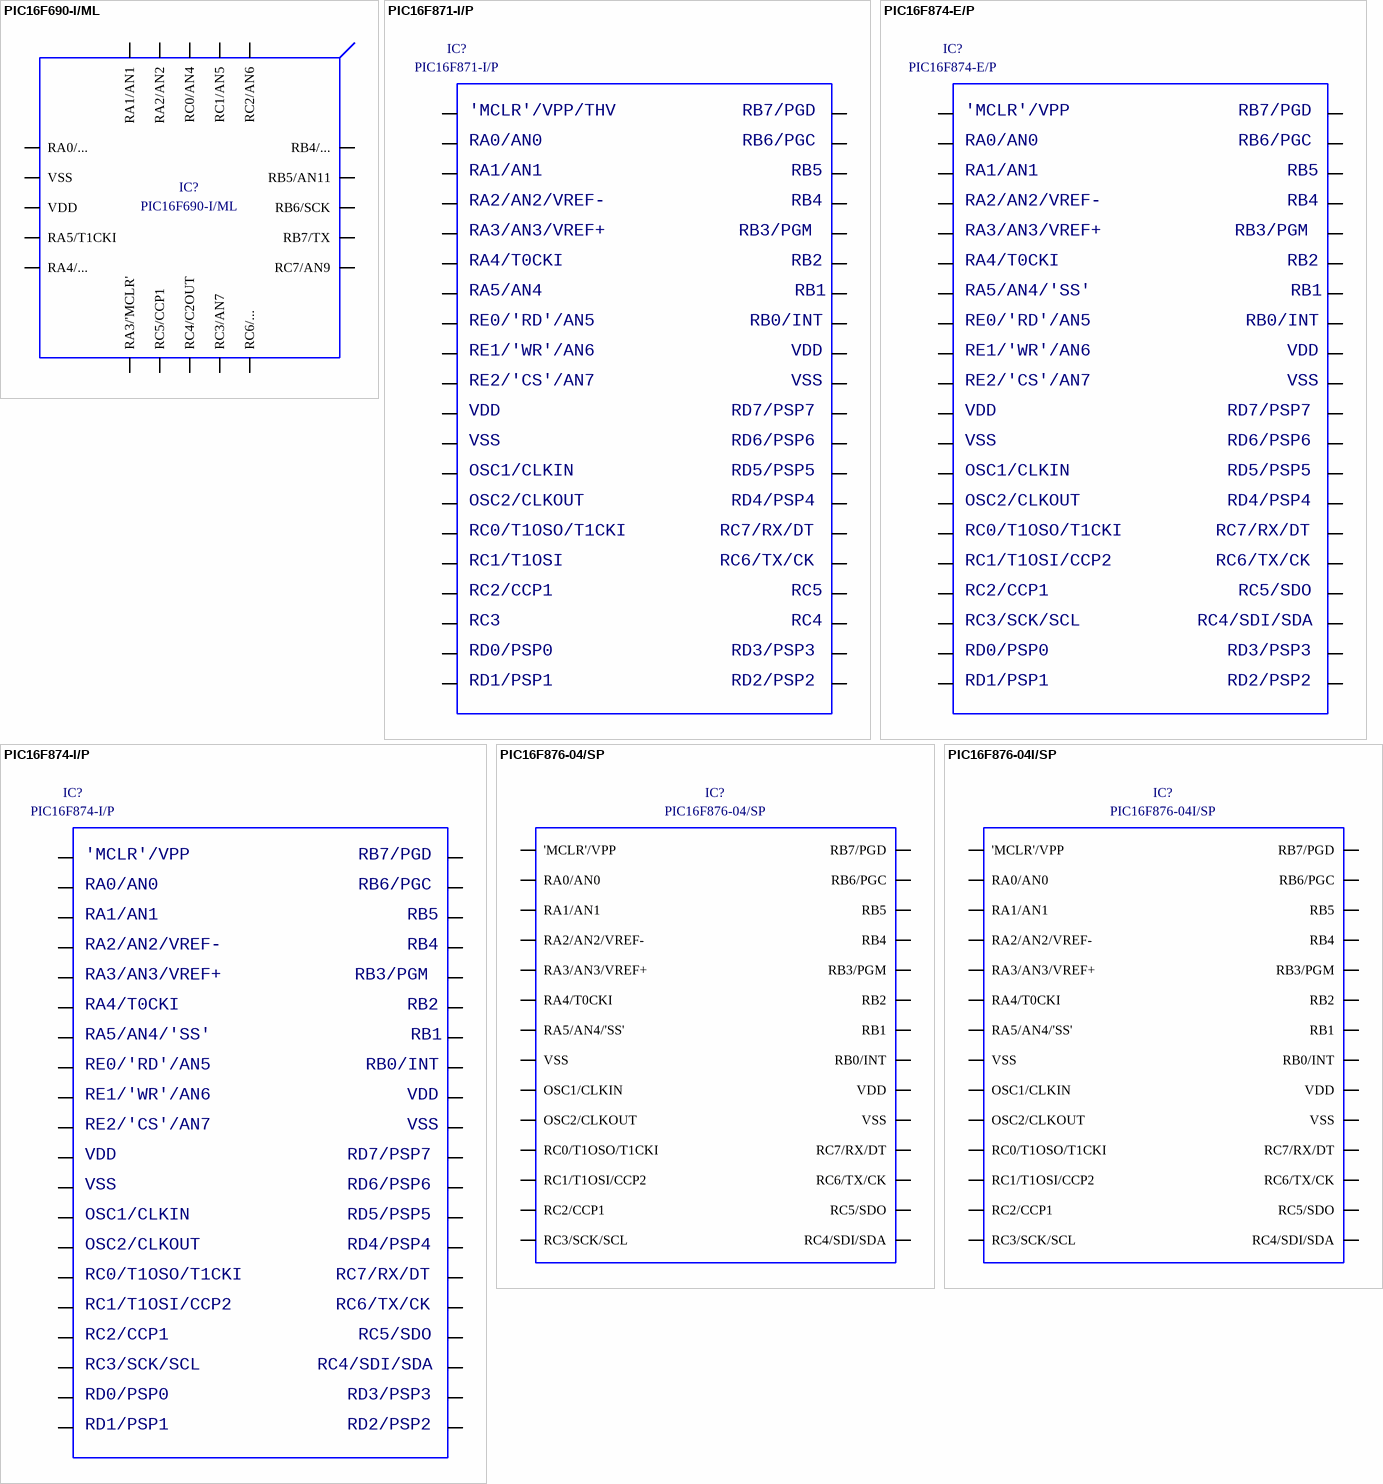
[diagram p160: symbols PIC16F690-I/ML to PIC16F876-04I/SP]

## PIC16F690-I/ML
designator IC?
20-Pin Flash-Based, 8-Bit CMOS Microcontroller
footprint smd QFN/20 (4x4mm p0.50mm)
pins: 1 RA3/'MCLR', 2 RC5/CCP1, 3 RC4/C2OUT, 4 RC3/AN7, 5 RC6/..., 6 RC7/AN9, 7 RB7/TX, 8 RB6/SCK, 9 RB5/AN11, 10 RB4/..., 11 RC2/AN6, 12 RC1/AN5, 13 RC0/AN4, 14 RA2/AN2, 15 RA1/AN1, 16 RA0/..., 17 VSS, 18 VDD, 19 RA5/T1CKI, 20 RA4/..., 21

## PIC16F871-I/P
designator IC?
8-bit cmos flash microcontroller unit
footprint icv DIP40-600
pins: 1, 2, 3, 4, 5, 6, 7, 8, 9, 10, 11, 12, 13, 14, 15, 16, 17, 18, 19, 20, 21, 22, 23, 24, 25, 26, 27, 28, 29, 30, 31, 32, 33, 34, 35, 36, 37, 38, 39, 40
text: 'MCLR'/VPP/THV; RB7/PGD; RA0/AN0; RB6/PGC; RA1/AN1; RB5; RA2/AN2/VREF-; RB4; RA3/AN3/VREF+; RB3/PGM; RA4/T0CKI; RB2; RA5/AN4; RB1; RE0/'RD'/AN5; RB0/INT; RE1/'WR'/AN6; VDD; RE2/'CS'/AN7; VSS; RD7/PSP7; RD6/PSP6; OSC1/CLKIN; RD5/PSP5; OSC2/CLKOUT; RD4/PSP4; RC0/T1OSO/T1CKI; RC7/RX/DT; RC1/T1OSI; RC6/TX/CK; RC2/CCP1; RC5; RC3; RC4; RD0/PSP0; RD3/PSP3; RD1/PSP1; RD2/PSP2

## PIC16F874-E/P
designator IC?
8-bit cmos flash microcontroller unit; Part Number: PIC16F874-E/P; Component Kind: Standard; Component Type: Standard; Designator: PIC16F874-E/P; Footprint: icv DIP40-600; Library Reference: PIC16F874-E/P; Pin Count: 40
footprint icv DIP40-600
pins: 1, 2, 3, 4, 5, 6, 7, 8, 9, 10, 11, 12, 13, 14, 15, 16, 17, 18, 19, 20, 21, 22, 23, 24, 25, 26, 27, 28, 29, 30, 31, 32, 33, 34, 35, 36, 37, 38, 39, 40
text: 'MCLR'/VPP; RB7/PGD; RA0/AN0; RB6/PGC; RA1/AN1; RB5; RA2/AN2/VREF-; RB4; RA3/AN3/VREF+; RB3/PGM; RA4/T0CKI; RB2; RA5/AN4/'SS'; RB1; RE0/'RD'/AN5; RB0/INT; RE1/'WR'/AN6; VDD; RE2/'CS'/AN7; VSS; RD7/PSP7; RD6/PSP6; OSC1/CLKIN; RD5/PSP5; OSC2/CLKOUT; RD4/PSP4; RC0/T1OSO/T1CKI; RC7/RX/DT; RC1/T1OSI/CCP2; RC6/TX/CK; RC2/CCP1; RC5/SDO; RC3/SCK/SCL; RC4/SDI/SDA; RD0/PSP0; RD3/PSP3; RD1/PSP1; RD2/PSP2

## PIC16F874-I/P
designator IC?
8-bit cmos flash microcontroller unit
footprint icv DIP40-600
pins: 1, 2, 3, 4, 5, 6, 7, 8, 9, 10, 11, 12, 13, 14, 15, 16, 17, 18, 19, 20, 21, 22, 23, 24, 25, 26, 27, 28, 29, 30, 31, 32, 33, 34, 35, 36, 37, 38, 39, 40
text: 'MCLR'/VPP; RB7/PGD; RA0/AN0; RB6/PGC; RA1/AN1; RB5; RA2/AN2/VREF-; RB4; RA3/AN3/VREF+; RB3/PGM; RA4/T0CKI; RB2; RA5/AN4/'SS'; RB1; RE0/'RD'/AN5; RB0/INT; RE1/'WR'/AN6; VDD; RE2/'CS'/AN7; VSS; RD7/PSP7; RD6/PSP6; OSC1/CLKIN; RD5/PSP5; OSC2/CLKOUT; RD4/PSP4; RC0/T1OSO/T1CKI; RC7/RX/DT; RC1/T1OSI/CCP2; RC6/TX/CK; RC2/CCP1; RC5/SDO; RC3/SCK/SCL; RC4/SDI/SDA; RD0/PSP0; RD3/PSP3; RD1/PSP1; RD2/PSP2

## PIC16F876-04/SP
designator IC?
8-bit cmos flash microcontroller unit
footprint icv DIP28-300
pins: 1 'MCLR'/VPP, 2 RA0/AN0, 3 RA1/AN1, 4 RA2/AN2/VREF-, 5 RA3/AN3/VREF+, 6 RA4/T0CKI, 7 RA5/AN4/'SS', 8 VSS, 9 OSC1/CLKIN, 10 OSC2/CLKOUT, 11 RC0/T1OSO/T1CKI, 12 RC1/T1OSI/CCP2, 13 RC2/CCP1, 14 RC3/SCK/SCL, 15 RC4/SDI/SDA, 16 RC5/SDO, 17 RC6/TX/CK, 18 RC7/RX/DT, 19 VSS, 20 VDD, 21 RB0/INT, 22 RB1, 23 RB2, 24 RB3/PGM, 25 RB4, 26 RB5, 27 RB6/PGC, 28 RB7/PGD

## PIC16F876-04I/SP
designator IC?
8-bit cmos flash microcontroller unit; Part Number: PIC16F876-04I/SP; Component Kind: Standard; Component Type: Standard; Designator: PIC16F876-04I/SP; Footprint: icv DIP28-300; Library Reference: PIC16F876-04I/SP; Pin Count: 28
footprint icv DIP28-300
pins: 1 'MCLR'/VPP, 2 RA0/AN0, 3 RA1/AN1, 4 RA2/AN2/VREF-, 5 RA3/AN3/VREF+, 6 RA4/T0CKI, 7 RA5/AN4/'SS', 8 VSS, 9 OSC1/CLKIN, 10 OSC2/CLKOUT, 11 RC0/T1OSO/T1CKI, 12 RC1/T1OSI/CCP2, 13 RC2/CCP1, 14 RC3/SCK/SCL, 15 RC4/SDI/SDA, 16 RC5/SDO, 17 RC6/TX/CK, 18 RC7/RX/DT, 19 VSS, 20 VDD, 21 RB0/INT, 22 RB1, 23 RB2, 24 RB3/PGM, 25 RB4, 26 RB5, 27 RB6/PGC, 28 RB7/PGD

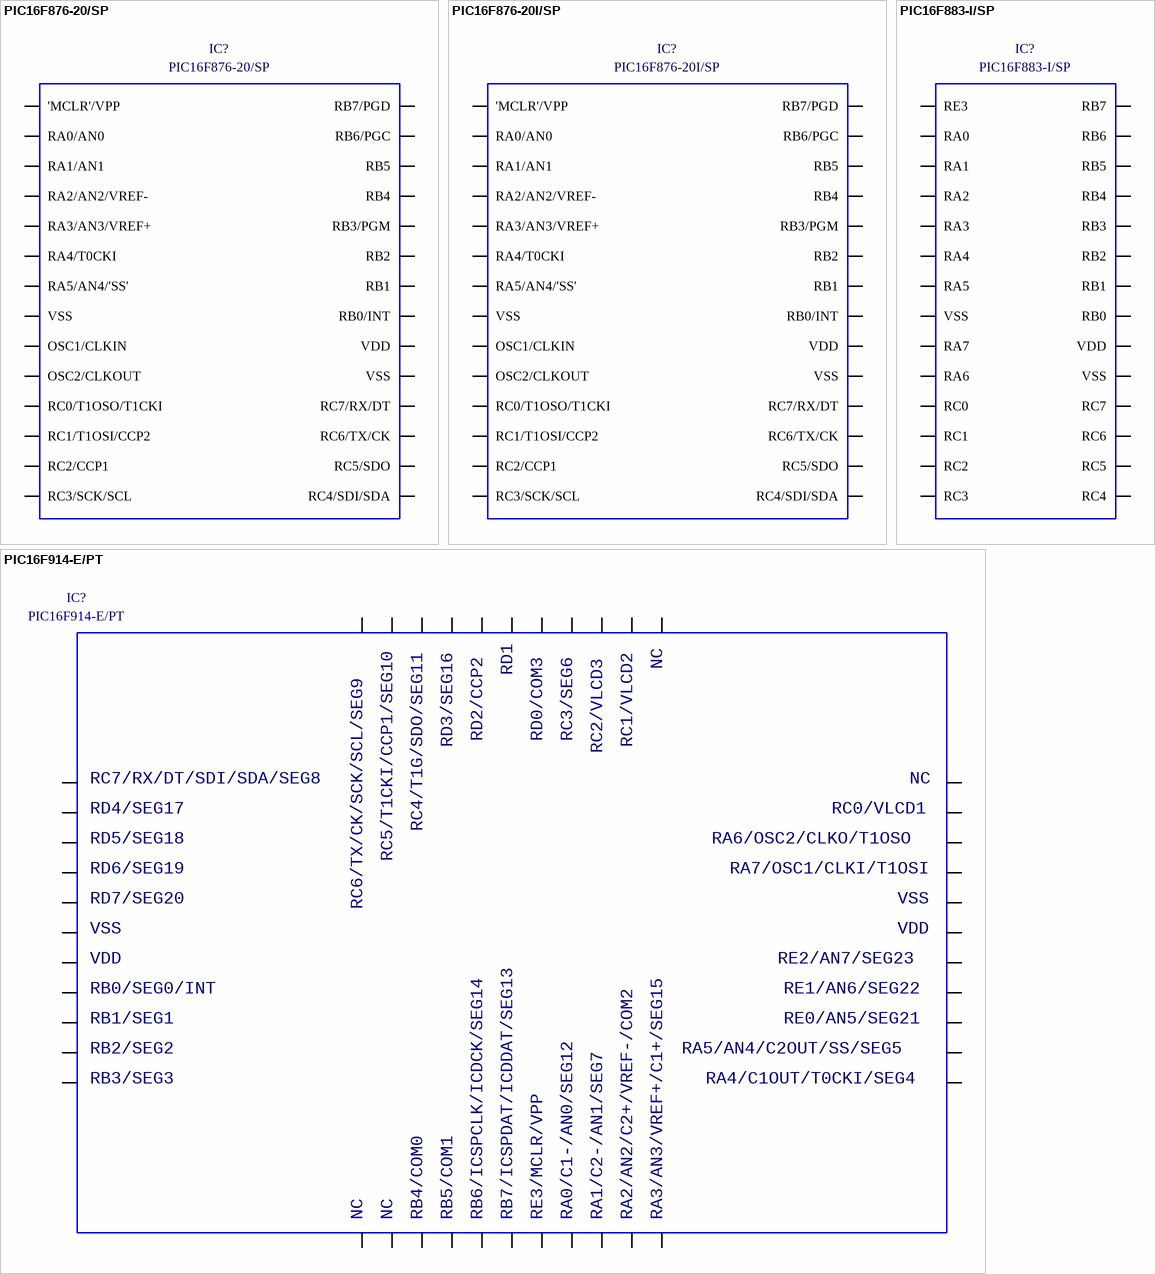
[diagram p161: symbols PIC16F876-20/SP to PIC16F914-E/PT]

## PIC16F876-20/SP
designator IC?
8-bit cmos flash microcontroller unit; Part Number: PIC16F876-20/SP; Component Kind: Standard; Component Type: Standard; Designator: PIC16F876-20/SP; Footprint: icv DIP28-300; Library Reference: PIC16F876-20/SP; Pin Count: 28
footprint icv DIP28-300
pins: 1 'MCLR'/VPP, 2 RA0/AN0, 3 RA1/AN1, 4 RA2/AN2/VREF-, 5 RA3/AN3/VREF+, 6 RA4/T0CKI, 7 RA5/AN4/'SS', 8 VSS, 9 OSC1/CLKIN, 10 OSC2/CLKOUT, 11 RC0/T1OSO/T1CKI, 12 RC1/T1OSI/CCP2, 13 RC2/CCP1, 14 RC3/SCK/SCL, 15 RC4/SDI/SDA, 16 RC5/SDO, 17 RC6/TX/CK, 18 RC7/RX/DT, 19 VSS, 20 VDD, 21 RB0/INT, 22 RB1, 23 RB2, 24 RB3/PGM, 25 RB4, 26 RB5, 27 RB6/PGC, 28 RB7/PGD

## PIC16F876-20I/SP
designator IC?
8-bit cmos flash microcontroller unit; Part Number: PIC16F876-20I/SP; Component Kind: Standard; Component Type: Standard; Designator: PIC16F876-20I/SP; Footprint: icv DIP28-300; Library Reference: PIC16F876-20I/SP; Pin Count: 28
footprint icv DIP28-300
pins: 1 'MCLR'/VPP, 2 RA0/AN0, 3 RA1/AN1, 4 RA2/AN2/VREF-, 5 RA3/AN3/VREF+, 6 RA4/T0CKI, 7 RA5/AN4/'SS', 8 VSS, 9 OSC1/CLKIN, 10 OSC2/CLKOUT, 11 RC0/T1OSO/T1CKI, 12 RC1/T1OSI/CCP2, 13 RC2/CCP1, 14 RC3/SCK/SCL, 15 RC4/SDI/SDA, 16 RC5/SDO, 17 RC6/TX/CK, 18 RC7/RX/DT, 19 VSS, 20 VDD, 21 RB0/INT, 22 RB1, 23 RB2, 24 RB3/PGM, 25 RB4, 26 RB5, 27 RB6/PGC, 28 RB7/PGD

## PIC16F883-I/SP
designator IC?
8-bit cmos flash microcontroller unit
footprint icv DIP28-300
pins: 1 RE3, 2 RA0, 3 RA1, 4 RA2, 5 RA3, 6 RA4, 7 RA5, 8 VSS, 9 RA7, 10 RA6, 11 RC0, 12 RC1, 13 RC2, 14 RC3, 15 RC4, 16 RC5, 17 RC6, 18 RC7, 19 VSS, 20 VDD, 21 RB0, 22 RB1, 23 RB2, 24 RB3, 25 RB4, 26 RB5, 27 RB6, 28 RB7

## PIC16F914-E/PT
designator IC?
Flash-Based, 8-Bit CMOS Microcontroller; Part Number: PIC16F914-E/PT; Component Kind: Standard; Component Type: Standard; Designator: PIC16F914-E/PT; Footprint: smd TQFP/44; Library Reference: PIC16F914-E/PT; Pin Count: 44
footprint smd TQFP/44
pins: 1, 2, 3, 4, 5, 6, 7, 8, 9, 10, 11, 12, 13, 14, 15, 16, 17, 18, 19, 20, 21, 22, 23, 24, 25, 26, 27, 28, 29, 30, 31, 32, 33, 34, 35, 36, 37, 38, 39, 40, 41, 42, 43, 44
text: NC; RD1; RD3/SEG16; RD2/CCP2; RD0/COM3; RC3/SEG6; RC1/VLCD2; RC2/VLCD3; RC7/RX/DT/SDI/SDA/SEG8; RD4/SEG17; RC0/VLCD1; RC4/T1G/SDO/SEG11; RD5/SEG18; RA6/OSC2/CLKO/T1OSO; RC5/T1CKI/CCP1/SEG10; RD6/SEG19; RA7/OSC1/CLKI/T1OSI; RD7/SEG20; RC6/TX/CK/SCK/SCL/SEG9; VSS; VDD; RE2/AN7/SEG23; RB0/SEG0/INT; RE1/AN6/SEG22; RB1/SEG1; RE0/AN5/SEG21; RB2/SEG2; RA5/AN4/C2OUT/SS/SEG5; RB3/SEG3; RA4/C1OUT/T0CKI/SEG4; RB4/COM0; RB5/COM1; RB6/ICSPCLK/ICDCK/SEG14; RB7/ICSPDAT/ICDDAT/SEG13; RE3/MCLR/VPP; RA0/C1-/AN0/SEG12; RA1/C2-/AN1/SEG7; RA2/AN2/C2+/VREF-/COM2; RA3/AN3/VREF+/C1+/SEG15

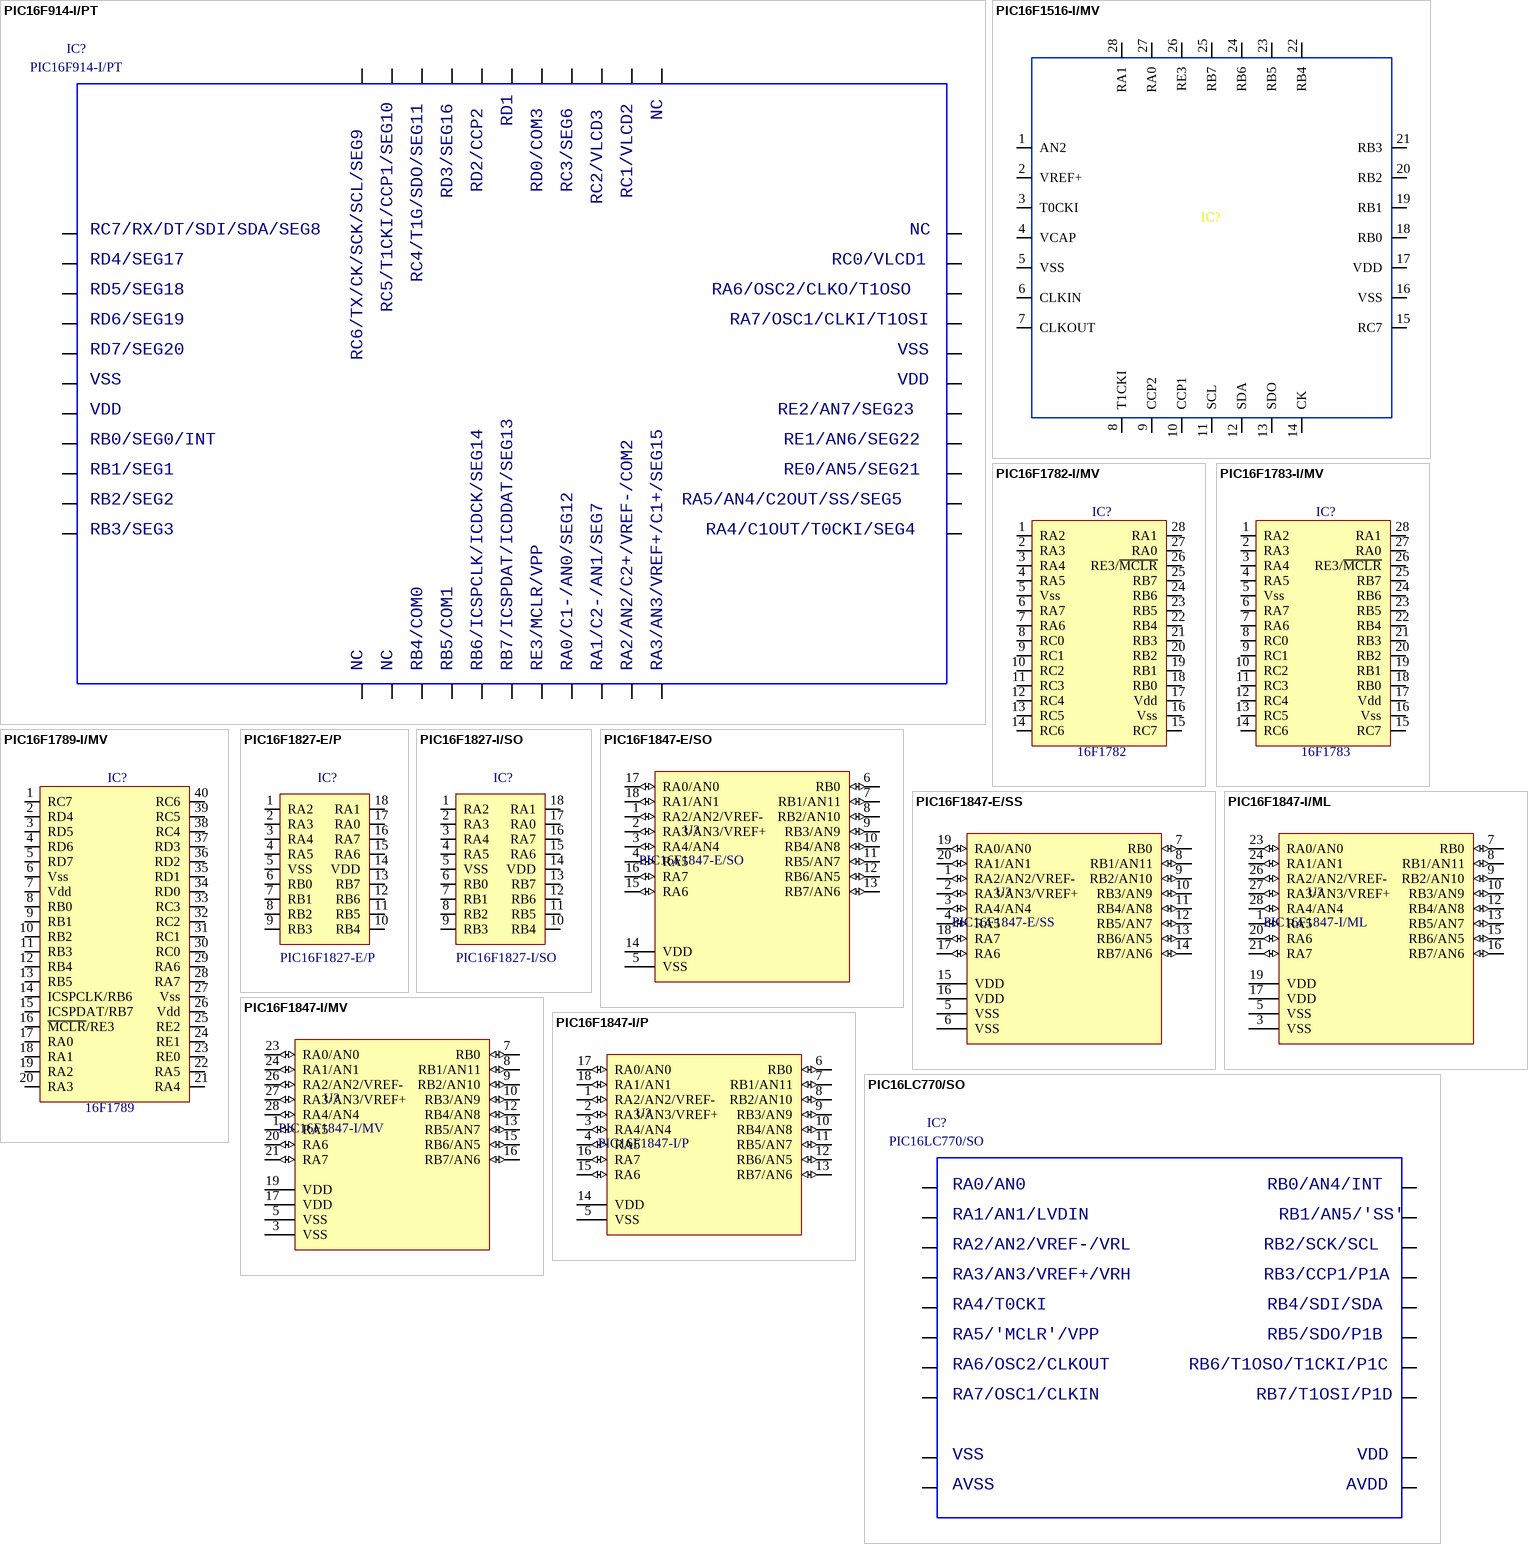
[diagram p162: symbols PIC16F914-I/PT to PIC16LC770/SO]

## PIC16F914-I/PT
designator IC?
Flash-Based, 8-Bit CMOS Microcontroller
footprint smd TQFP/44
pins: 1, 2, 3, 4, 5, 6, 7, 8, 9, 10, 11, 12, 13, 14, 15, 16, 17, 18, 19, 20, 21, 22, 23, 24, 25, 26, 27, 28, 29, 30, 31, 32, 33, 34, 35, 36, 37, 38, 39, 40, 41, 42, 43, 44
text: NC; RD1; RD3/SEG16; RD2/CCP2; RD0/COM3; RC3/SEG6; RC1/VLCD2; RC2/VLCD3; RC7/RX/DT/SDI/SDA/SEG8; RD4/SEG17; RC0/VLCD1; RC4/T1G/SDO/SEG11; RD5/SEG18; RA6/OSC2/CLKO/T1OSO; RC5/T1CKI/CCP1/SEG10; RD6/SEG19; RA7/OSC1/CLKI/T1OSI; RD7/SEG20; RC6/TX/CK/SCK/SCL/SEG9; VSS; VDD; RE2/AN7/SEG23; RB0/SEG0/INT; RE1/AN6/SEG22; RB1/SEG1; RE0/AN5/SEG21; RB2/SEG2; RA5/AN4/C2OUT/SS/SEG5; RB3/SEG3; RA4/C1OUT/T0CKI/SEG4; RB4/COM0; RB5/COM1; RB6/ICSPCLK/ICDCK/SEG14; RB7/ICSPDAT/ICDDAT/SEG13; RE3/MCLR/VPP; RA0/C1-/AN0/SEG12; RA1/C2-/AN1/SEG7; RA2/AN2/C2+/VREF-/COM2; RA3/AN3/VREF+/C1+/SEG15

## PIC16F1516-I/MV
designator IC?  (value not drawn)
Flash Microcontrollers with nanoWatt XLP Technology; Part Number: PIC16F1516-I/MV; Component Kind: Standard; Component Type: Standard; Designator: PIC16F1516-I/MV; Footprint: smd UQFN/28 (4x4mm); Library Reference: PIC16F1516-I/MV; Pin Count: 28
footprint smd UQFN/28 (4x4mm)
pins: 1 AN2, 2 VREF+, 3 T0CKI, 4 VCAP, 5 VSS, 6 CLKIN, 7 CLKOUT, 8 T1CKI, 9 CCP2, 10 CCP1, 11 SCL, 12 SDA, 13 SDO, 14 CK, 15 RC7, 16 VSS, 17 VDD, 18 RB0, 19 RB1, 20 RB2, 21 RB3, 22 RB4, 23 RB5, 24 RB6, 25 RB7, 26 RE3, 27 RA0, 28 RA1

## PIC16F1782-I/MV
designator IC?, comment 16F1782
8-bit microcontroller
footprint smd UQFN/28 (4x4mm)
pins: 1 RA2, 2 RA3, 3 RA4, 4 RA5, 5 Vss, 6 RA7, 7 RA6, 8 RC0, 9 RC1, 10 RC2, 11 RC3, 12 RC4, 13 RC5, 14 RC6, 15 RC7, 16 Vss, 17 Vdd, 18 RB0, 19 RB1, 20 RB2, 21 RB3, 22 RB4, 23 RB5, 24 RB6, 25 RB7, 26 RE3/~{MCLR}, 27 RA0, 28 RA1

## PIC16F1783-I/MV
designator IC?, comment 16F1783
8-bit microcontroller
footprint smd UQFN/28 (4x4mm)
pins: 1 RA2, 2 RA3, 3 RA4, 4 RA5, 5 Vss, 6 RA7, 7 RA6, 8 RC0, 9 RC1, 10 RC2, 11 RC3, 12 RC4, 13 RC5, 14 RC6, 15 RC7, 16 Vss, 17 Vdd, 18 RB0, 19 RB1, 20 RB2, 21 RB3, 22 RB4, 23 RB5, 24 RB6, 25 RB7, 26 RE3/~{MCLR}, 27 RA0, 28 RA1

## PIC16F1789-I/MV
designator IC?, comment 16F1789
8-bit microcontroller
footprint smd uQFN/40 (5x5mm p0.40mm) - duplicate
pins: 1 RC7, 2 RD4, 3 RD5, 4 RD6, 5 RD7, 6 Vss, 7 Vdd, 8 RB0, 9 RB1, 10 RB2, 11 RB3, 12 RB4, 13 RB5, 14 ICSPCLK/RB6, 15 ICSPDAT/RB7, 16 ~{MCLR}/RE3, 17 RA0, 18 RA1, 19 RA2, 20 RA3, 21 RA4, 22 RA5, 23 RE0, 24 RE1, 25 RE2, 26 Vdd, 27 Vss, 28 RA7, 29 RA6, 30 RC0, 31 RC1, 32 RC2, 33 RC3, 34 RD0, 35 RD1, 36 RD2, 37 RD3, 38 RC4, 39 RC5, 40 RC6

## PIC16F1827-E/P
designator IC?
footprint icv DIP18-300
pins: 1 RA2, 2 RA3, 3 RA4, 4 RA5, 5 VSS, 6 RB0, 7 RB1, 8 RB2, 9 RB3, 10 RB4, 11 RB5, 12 RB6, 13 RB7, 14 VDD, 15 RA6, 16 RA7, 17 RA0, 18 RA1

## PIC16F1827-I/SO
designator IC?
footprint smd soicw/18
pins: 1 RA2, 2 RA3, 3 RA4, 4 RA5, 5 VSS, 6 RB0, 7 RB1, 8 RB2, 9 RB3, 10 RB4, 11 RB5, 12 RB6, 13 RB7, 14 VDD, 15 RA6, 16 RA7, 17 RA0, 18 RA1

## PIC16F1847-E/SO
designator U?
Manufacturer: Microchip
footprint smd SOICW/18
pins: 1 RA2/AN2/VREF- (io), 2 RA3/AN3/VREF+ (io), 3 RA4/AN4 (io), 4 RA5 (io), 5 VSS (power), 6 RB0 (io), 7 RB1/AN11 (io), 8 RB2/AN10 (io), 9 RB3/AN9 (io), 10 RB4/AN8 (io), 11 RB5/AN7 (io), 12 RB6/AN5 (io), 13 RB7/AN6 (io), 14 VDD (power), 15 RA6 (io), 16 RA7 (io), 17 RA0/AN0 (io), 18 RA1/AN1 (io)

## PIC16F1847-E/SS
designator U?
Manufacturer: Microchip
footprint smd SSOP/20 (body 5.3 pitch 0.65)
pins: 1 RA2/AN2/VREF- (io), 2 RA3/AN3/VREF+ (io), 3 RA4/AN4 (io), 4 RA5 (io), 5 VSS (power), 6 VSS (power), 7 RB0 (io), 8 RB1/AN11 (io), 9 RB2/AN10 (io), 10 RB3/AN9 (io), 11 RB4/AN8 (io), 12 RB5/AN7 (io), 13 RB6/AN5 (io), 14 RB7/AN6 (io), 15 VDD (power), 16 VDD (power), 17 RA6 (io), 18 RA7 (io), 19 RA0/AN0 (io), 20 RA1/AN1 (io)

## PIC16F1847-I/ML
designator U?
Manufacturer: Microchip
footprint SMD QFN/28 (6X6MM)
pins: 1 RA5 (io), 3 VSS (power), 5 VSS (power), 7 RB0 (io), 8 RB1/AN11 (io), 9 RB2/AN10 (io), 10 RB3/AN9 (io), 12 RB4/AN8 (io), 13 RB5/AN7 (io), 15 RB6/AN5 (io), 16 RB7/AN6 (io), 17 VDD (power), 19 VDD (power), 20 RA6 (io), 21 RA7 (io), 23 RA0/AN0 (io), 24 RA1/AN1 (io), 26 RA2/AN2/VREF- (io), 27 RA3/AN3/VREF+ (io), 28 RA4/AN4 (io)

## PIC16F1847-I/MV
designator U?
Manufacturer: Microchip
footprint smd UQFN/28 (4x4mm)
pins: 1 RA5 (io), 3 VSS (power), 5 VSS (power), 7 RB0 (io), 8 RB1/AN11 (io), 9 RB2/AN10 (io), 10 RB3/AN9 (io), 12 RB4/AN8 (io), 13 RB5/AN7 (io), 15 RB6/AN5 (io), 16 RB7/AN6 (io), 17 VDD (power), 19 VDD (power), 20 RA6 (io), 21 RA7 (io), 23 RA0/AN0 (io), 24 RA1/AN1 (io), 26 RA2/AN2/VREF- (io), 27 RA3/AN3/VREF+ (io), 28 RA4/AN4 (io)

## PIC16F1847-I/P
designator U?
Manufacturer: Micochip
footprint icv DIP18-300
pins: 1 RA2/AN2/VREF- (io), 2 RA3/AN3/VREF+ (io), 3 RA4/AN4 (io), 4 RA5 (io), 5 VSS (power), 6 RB0 (io), 7 RB1/AN11 (io), 8 RB2/AN10 (io), 9 RB3/AN9 (io), 10 RB4/AN8 (io), 11 RB5/AN7 (io), 12 RB6/AN5 (io), 13 RB7/AN6 (io), 14 VDD (power), 15 RA6 (io), 16 RA7 (io), 17 RA0/AN0 (io), 18 RA1/AN1 (io)

## PIC16LC770/SO
designator IC?
8-bit cmos microcontroller unit; Part Number: PIC16LC770/SO; Component Kind: Standard; Component Type: Standard; Designator: PIC16LC770/SO; Footprint: smd SOICW/20; Library Reference: PIC16LC770/SO; Pin Count: 20
footprint smd SOICW/20
pins: 1, 2, 3, 4, 5, 6, 7, 8, 9, 10, 11, 12, 13, 14, 15, 16, 17, 18, 19, 20
text: RA0/AN0; RB0/AN4/INT; RA1/AN1/LVDIN; RB1/AN5/'SS'; RA2/AN2/VREF-/VRL; RB2/SCK/SCL; RA3/AN3/VREF+/VRH; RB3/CCP1/P1A; RA4/T0CKI; RB4/SDI/SDA; RA5/'MCLR'/VPP; RB5/SDO/P1B; RA6/OSC2/CLKOUT; RB6/T1OSO/T1CKI/P1C; RA7/OSC1/CLKIN; RB7/T1OSI/P1D; VSS; VDD; AVSS; AVDD

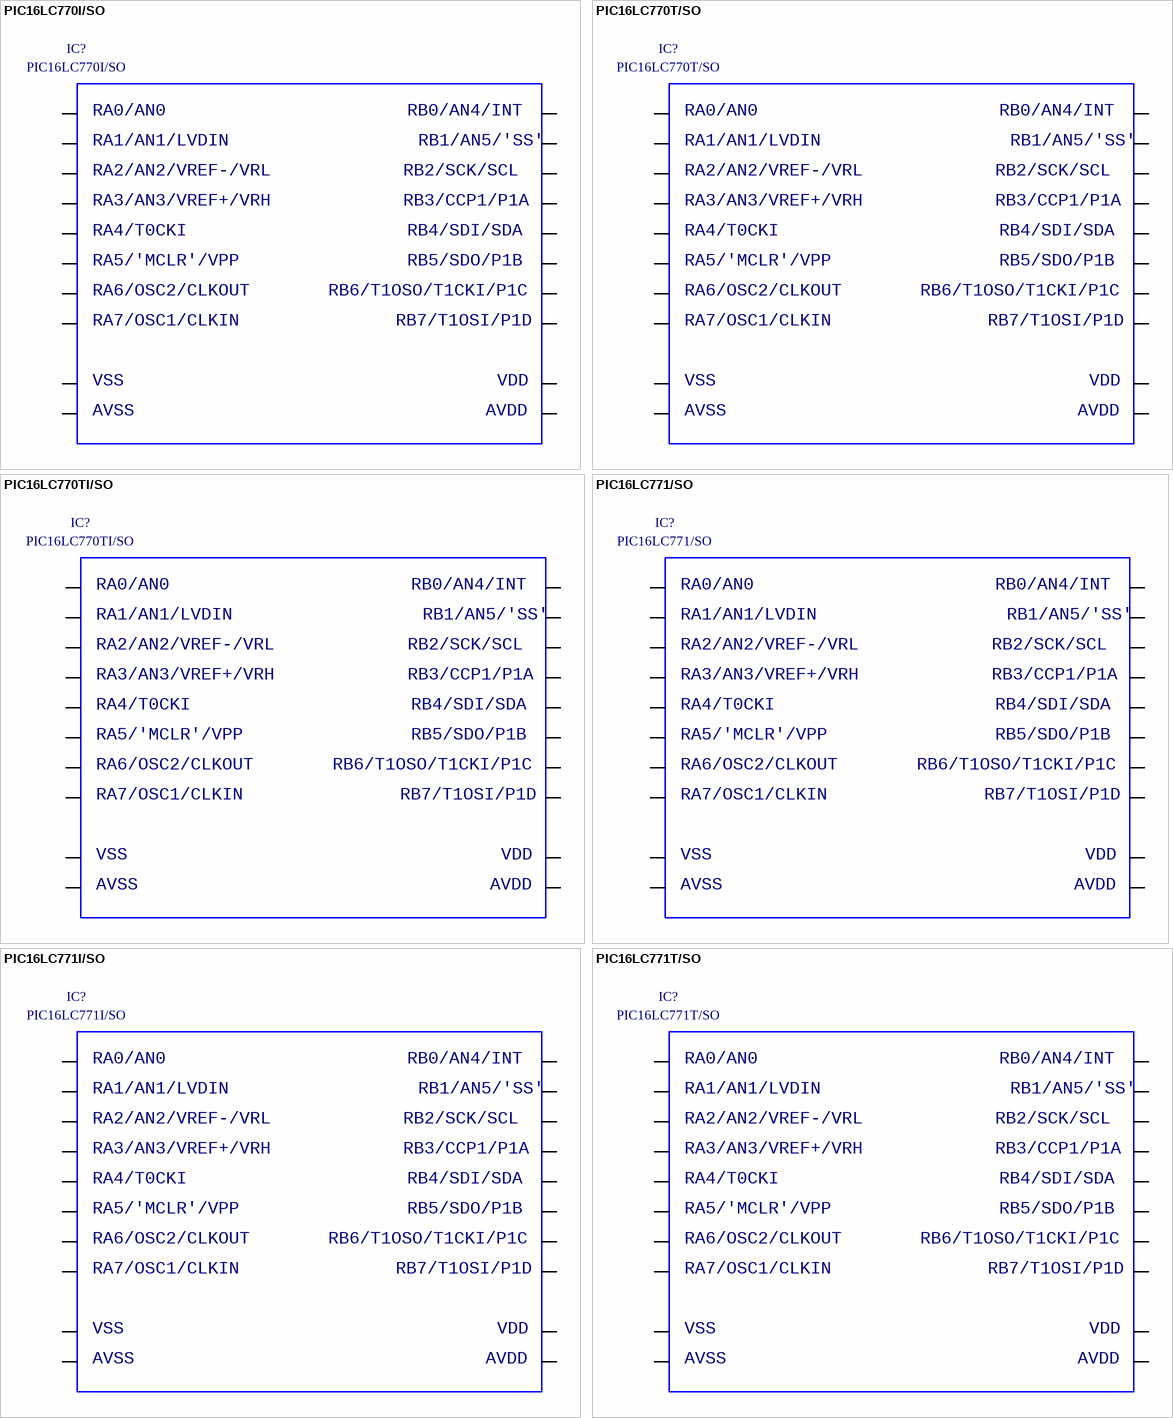
[diagram p163: symbols PIC16LC770I/SO to PIC16LC771T/SO]

## PIC16LC770I/SO
designator IC?
8-bit cmos microcontroller unit; Part Number: PIC16LC770I/SO; Component Kind: Standard; Component Type: Standard; Designator: PIC16LC770I/SO; Footprint: smd SOICW/20; Library Reference: PIC16LC770I/SO; Pin Count: 20
footprint smd SOICW/20
pins: 1, 2, 3, 4, 5, 6, 7, 8, 9, 10, 11, 12, 13, 14, 15, 16, 17, 18, 19, 20
text: RA0/AN0; RB0/AN4/INT; RA1/AN1/LVDIN; RB1/AN5/'SS'; RA2/AN2/VREF-/VRL; RB2/SCK/SCL; RA3/AN3/VREF+/VRH; RB3/CCP1/P1A; RA4/T0CKI; RB4/SDI/SDA; RA5/'MCLR'/VPP; RB5/SDO/P1B; RA6/OSC2/CLKOUT; RB6/T1OSO/T1CKI/P1C; RA7/OSC1/CLKIN; RB7/T1OSI/P1D; VSS; VDD; AVSS; AVDD

## PIC16LC770T/SO
designator IC?
8-bit cmos microcontroller unit; Part Number: PIC16LC770T/SO; Component Kind: Standard; Component Type: Standard; Designator: PIC16LC770T/SO; Footprint: smd SOICW/20; Library Reference: PIC16LC770T/SO; Pin Count: 20
footprint smd SOICW/20
pins: 1, 2, 3, 4, 5, 6, 7, 8, 9, 10, 11, 12, 13, 14, 15, 16, 17, 18, 19, 20
text: RA0/AN0; RB0/AN4/INT; RA1/AN1/LVDIN; RB1/AN5/'SS'; RA2/AN2/VREF-/VRL; RB2/SCK/SCL; RA3/AN3/VREF+/VRH; RB3/CCP1/P1A; RA4/T0CKI; RB4/SDI/SDA; RA5/'MCLR'/VPP; RB5/SDO/P1B; RA6/OSC2/CLKOUT; RB6/T1OSO/T1CKI/P1C; RA7/OSC1/CLKIN; RB7/T1OSI/P1D; VSS; VDD; AVSS; AVDD

## PIC16LC770TI/SO
designator IC?
8-bit cmos microcontroller unit; Part Number: PIC16LC770TI/SO; Component Kind: Standard; Component Type: Standard; Designator: PIC16LC770TI/SO; Footprint: smd SOICW/20; Library Reference: PIC16LC770TI/SO; Pin Count: 20
footprint smd SOICW/20
pins: 1, 2, 3, 4, 5, 6, 7, 8, 9, 10, 11, 12, 13, 14, 15, 16, 17, 18, 19, 20
text: RA0/AN0; RB0/AN4/INT; RA1/AN1/LVDIN; RB1/AN5/'SS'; RA2/AN2/VREF-/VRL; RB2/SCK/SCL; RA3/AN3/VREF+/VRH; RB3/CCP1/P1A; RA4/T0CKI; RB4/SDI/SDA; RA5/'MCLR'/VPP; RB5/SDO/P1B; RA6/OSC2/CLKOUT; RB6/T1OSO/T1CKI/P1C; RA7/OSC1/CLKIN; RB7/T1OSI/P1D; VSS; VDD; AVSS; AVDD

## PIC16LC771/SO
designator IC?
8-bit cmos microcontroller unit; Part Number: PIC16LC771/SO; Component Kind: Standard; Component Type: Standard; Designator: PIC16LC771/SO; Footprint: smd SOICW/20; Library Reference: PIC16LC771/SO; Pin Count: 20
footprint smd SOICW/20
pins: 1, 2, 3, 4, 5, 6, 7, 8, 9, 10, 11, 12, 13, 14, 15, 16, 17, 18, 19, 20
text: RA0/AN0; RB0/AN4/INT; RA1/AN1/LVDIN; RB1/AN5/'SS'; RA2/AN2/VREF-/VRL; RB2/SCK/SCL; RA3/AN3/VREF+/VRH; RB3/CCP1/P1A; RA4/T0CKI; RB4/SDI/SDA; RA5/'MCLR'/VPP; RB5/SDO/P1B; RA6/OSC2/CLKOUT; RB6/T1OSO/T1CKI/P1C; RA7/OSC1/CLKIN; RB7/T1OSI/P1D; VSS; VDD; AVSS; AVDD

## PIC16LC771I/SO
designator IC?
8-bit cmos microcontroller unit; Part Number: PIC16LC771I/SO; Component Kind: Standard; Component Type: Standard; Designator: PIC16LC771I/SO; Footprint: smd SOICW/20; Library Reference: PIC16LC771I/SO; Pin Count: 20
footprint smd SOICW/20
pins: 1, 2, 3, 4, 5, 6, 7, 8, 9, 10, 11, 12, 13, 14, 15, 16, 17, 18, 19, 20
text: RA0/AN0; RB0/AN4/INT; RA1/AN1/LVDIN; RB1/AN5/'SS'; RA2/AN2/VREF-/VRL; RB2/SCK/SCL; RA3/AN3/VREF+/VRH; RB3/CCP1/P1A; RA4/T0CKI; RB4/SDI/SDA; RA5/'MCLR'/VPP; RB5/SDO/P1B; RA6/OSC2/CLKOUT; RB6/T1OSO/T1CKI/P1C; RA7/OSC1/CLKIN; RB7/T1OSI/P1D; VSS; VDD; AVSS; AVDD

## PIC16LC771T/SO
designator IC?
8-bit cmos microcontroller unit; Part Number: PIC16LC771T/SO; Component Kind: Standard; Component Type: Standard; Designator: PIC16LC771T/SO; Footprint: smd SOICW/20; Library Reference: PIC16LC771T/SO; Pin Count: 20
footprint smd SOICW/20
pins: 1, 2, 3, 4, 5, 6, 7, 8, 9, 10, 11, 12, 13, 14, 15, 16, 17, 18, 19, 20
text: RA0/AN0; RB0/AN4/INT; RA1/AN1/LVDIN; RB1/AN5/'SS'; RA2/AN2/VREF-/VRL; RB2/SCK/SCL; RA3/AN3/VREF+/VRH; RB3/CCP1/P1A; RA4/T0CKI; RB4/SDI/SDA; RA5/'MCLR'/VPP; RB5/SDO/P1B; RA6/OSC2/CLKOUT; RB6/T1OSO/T1CKI/P1C; RA7/OSC1/CLKIN; RB7/T1OSI/P1D; VSS; VDD; AVSS; AVDD

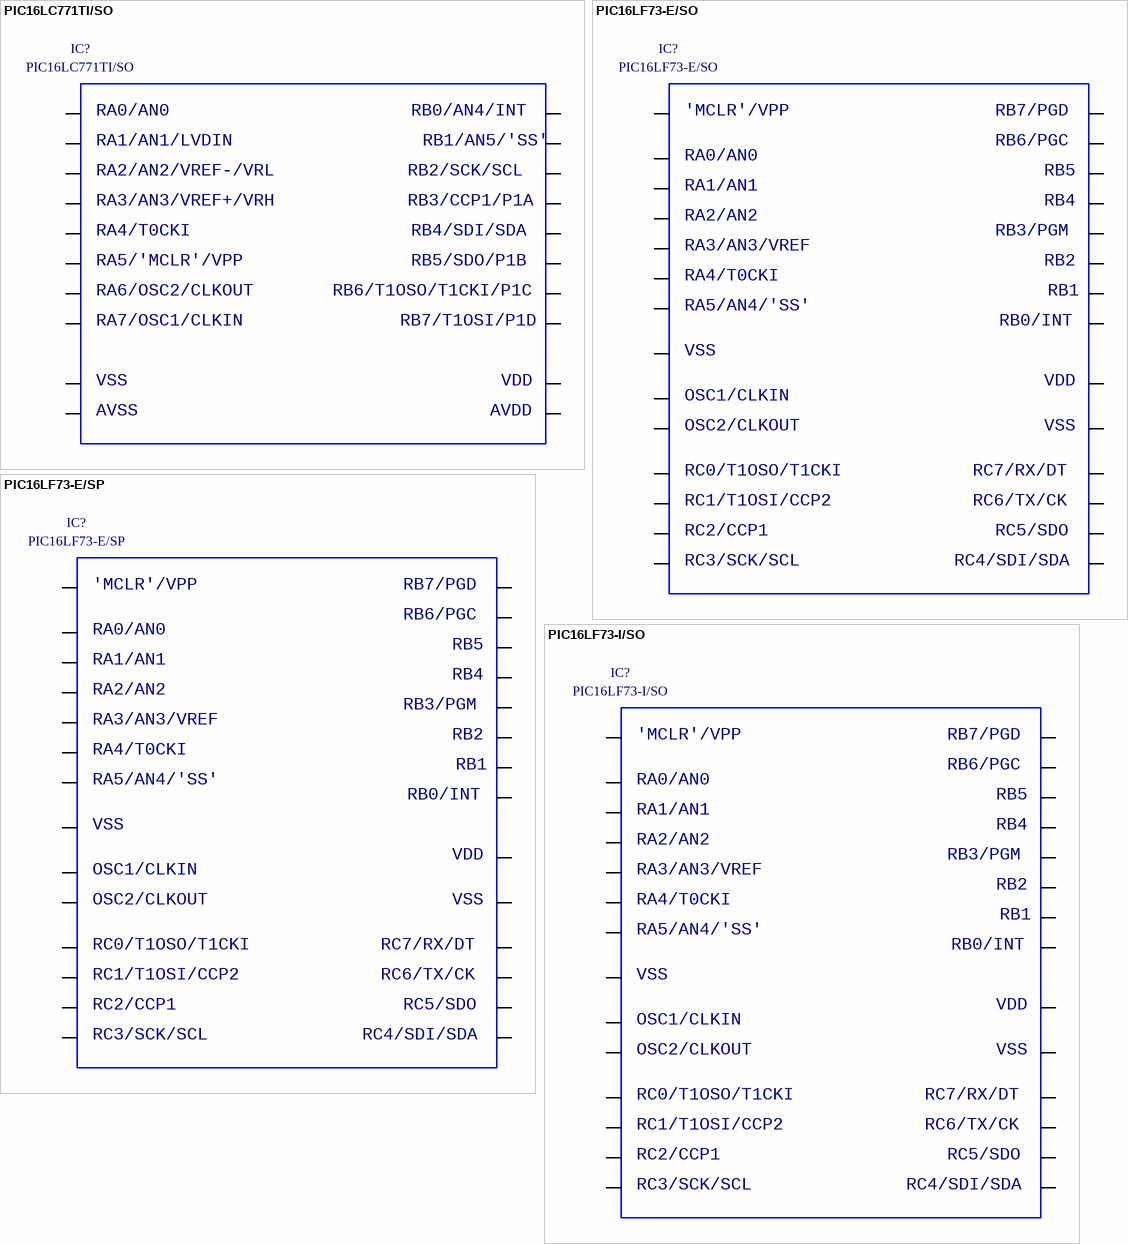
[diagram p164: symbols PIC16LC771TI/SO to PIC16LF73-I/SO]

## PIC16LC771TI/SO
designator IC?
8-bit cmos microcontroller unit; Part Number: PIC16LC771TI/SO; Component Kind: Standard; Component Type: Standard; Designator: PIC16LC771TI/SO; Footprint: smd SOICW/20; Library Reference: PIC16LC771TI/SO; Pin Count: 20
footprint smd SOICW/20
pins: 1, 2, 3, 4, 5, 6, 7, 8, 9, 10, 11, 12, 13, 14, 15, 16, 17, 18, 19, 20
text: RA0/AN0; RB0/AN4/INT; RA1/AN1/LVDIN; RB1/AN5/'SS'; RA2/AN2/VREF-/VRL; RB2/SCK/SCL; RA3/AN3/VREF+/VRH; RB3/CCP1/P1A; RA4/T0CKI; RB4/SDI/SDA; RA5/'MCLR'/VPP; RB5/SDO/P1B; RA6/OSC2/CLKOUT; RB6/T1OSO/T1CKI/P1C; RA7/OSC1/CLKIN; RB7/T1OSI/P1D; VSS; VDD; AVSS; AVDD

## PIC16LF73-E/SO
designator IC?
8-bit cmos flash microcontroller unit; Part Number: PIC16LF73-E/SO; Component Kind: Standard; Component Type: Standard; Designator: PIC16LF73-E/SO; Footprint: smd SOICW/28; Library Reference: PIC16LF73-E/SO; Pin Count: 28
footprint smd SOICW/28
pins: 1, 2, 3, 4, 5, 6, 7, 8, 9, 10, 11, 12, 13, 14, 15, 16, 17, 18, 19, 20, 21, 22, 23, 24, 25, 26, 27, 28
text: 'MCLR'/VPP; RB7/PGD; RB6/PGC; RA0/AN0; RB5; RA1/AN1; RB4; RA2/AN2; RB3/PGM; RA3/AN3/VREF; RB2; RA4/T0CKI; RB1; RA5/AN4/'SS'; RB0/INT; VSS; VDD; OSC1/CLKIN; OSC2/CLKOUT; RC0/T1OSO/T1CKI; RC7/RX/DT; RC1/T1OSI/CCP2; RC6/TX/CK; RC2/CCP1; RC5/SDO; RC3/SCK/SCL; RC4/SDI/SDA

## PIC16LF73-E/SP
designator IC?
8-bit cmos flash microcontroller unit; Part Number: PIC16LF73-E/SP; Component Kind: Standard; Component Type: Standard; Designator: PIC16LF73-E/SP; Footprint: icv DIP28-300; Library Reference: PIC16LF73-E/SP; Pin Count: 28
footprint icv DIP28-300
pins: 1, 2, 3, 4, 5, 6, 7, 8, 9, 10, 11, 12, 13, 14, 15, 16, 17, 18, 19, 20, 21, 22, 23, 24, 25, 26, 27, 28
text: 'MCLR'/VPP; RB7/PGD; RB6/PGC; RA0/AN0; RB5; RA1/AN1; RB4; RA2/AN2; RB3/PGM; RA3/AN3/VREF; RB2; RA4/T0CKI; RB1; RA5/AN4/'SS'; RB0/INT; VSS; VDD; OSC1/CLKIN; OSC2/CLKOUT; RC0/T1OSO/T1CKI; RC7/RX/DT; RC1/T1OSI/CCP2; RC6/TX/CK; RC2/CCP1; RC5/SDO; RC3/SCK/SCL; RC4/SDI/SDA

## PIC16LF73-I/SO
designator IC?
8-bit cmos flash microcontroller unit; Part Number: PIC16LF73-I/SO; Component Kind: Standard; Component Type: Standard; Designator: PIC16LF73-I/SO; Footprint: smd SOICW/28; Library Reference: PIC16LF73-I/SO; Pin Count: 28
footprint smd SOICW/28
pins: 1, 2, 3, 4, 5, 6, 7, 8, 9, 10, 11, 12, 13, 14, 15, 16, 17, 18, 19, 20, 21, 22, 23, 24, 25, 26, 27, 28
text: 'MCLR'/VPP; RB7/PGD; RB6/PGC; RA0/AN0; RB5; RA1/AN1; RB4; RA2/AN2; RB3/PGM; RA3/AN3/VREF; RB2; RA4/T0CKI; RB1; RA5/AN4/'SS'; RB0/INT; VSS; VDD; OSC1/CLKIN; OSC2/CLKOUT; RC0/T1OSO/T1CKI; RC7/RX/DT; RC1/T1OSI/CCP2; RC6/TX/CK; RC2/CCP1; RC5/SDO; RC3/SCK/SCL; RC4/SDI/SDA

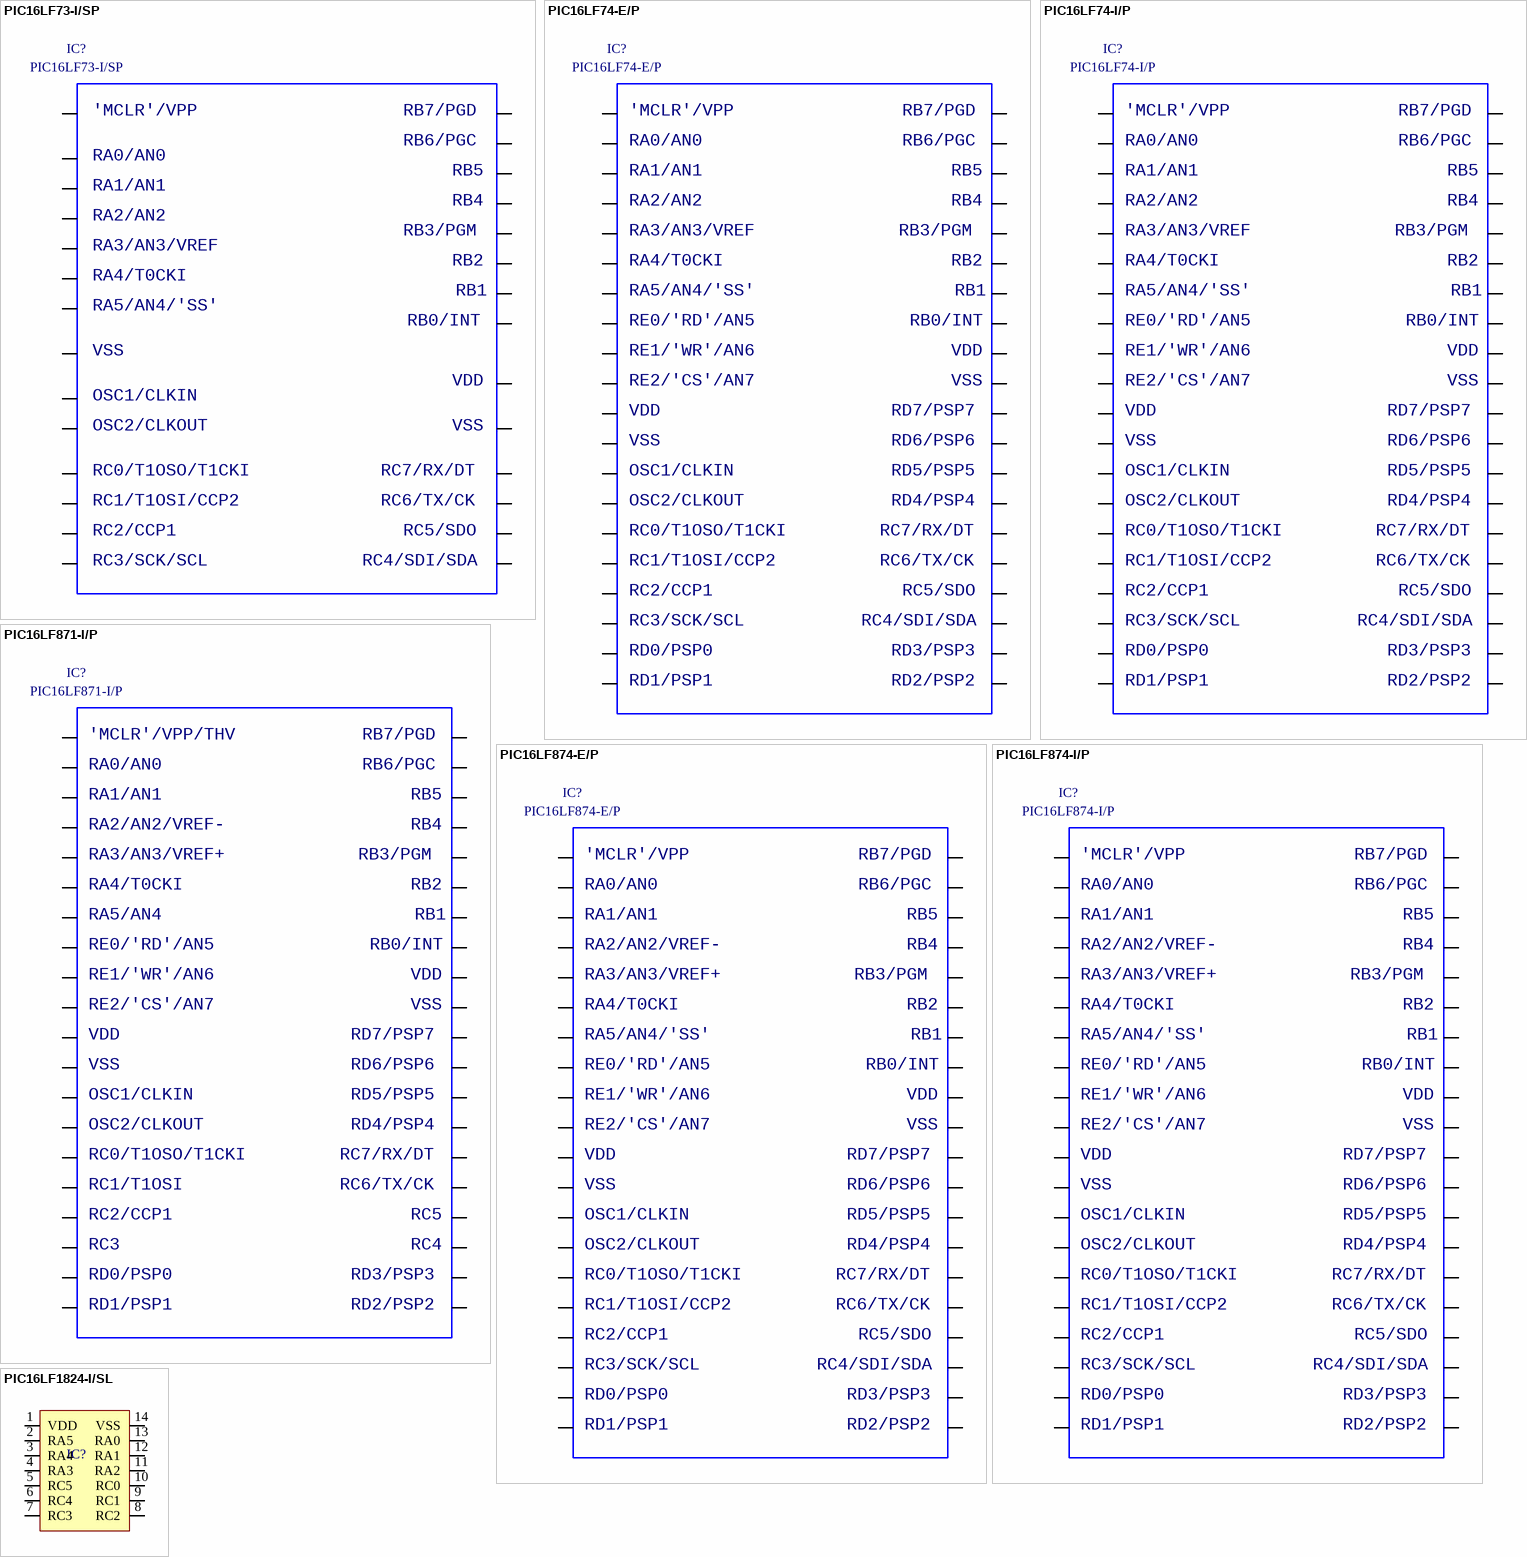
[diagram p165: symbols PIC16LF73-I/SP to PIC16LF1824-I/SL]

## PIC16LF73-I/SP
designator IC?
8-bit cmos flash microcontroller unit; Part Number: PIC16LF73-I/SP; Component Kind: Standard; Component Type: Standard; Designator: PIC16LF73-I/SP; Footprint: icv DIP28-300; Library Reference: PIC16LF73-I/SP; Pin Count: 28
footprint icv DIP28-300
pins: 1, 2, 3, 4, 5, 6, 7, 8, 9, 10, 11, 12, 13, 14, 15, 16, 17, 18, 19, 20, 21, 22, 23, 24, 25, 26, 27, 28
text: 'MCLR'/VPP; RB7/PGD; RB6/PGC; RA0/AN0; RB5; RA1/AN1; RB4; RA2/AN2; RB3/PGM; RA3/AN3/VREF; RB2; RA4/T0CKI; RB1; RA5/AN4/'SS'; RB0/INT; VSS; VDD; OSC1/CLKIN; OSC2/CLKOUT; RC0/T1OSO/T1CKI; RC7/RX/DT; RC1/T1OSI/CCP2; RC6/TX/CK; RC2/CCP1; RC5/SDO; RC3/SCK/SCL; RC4/SDI/SDA

## PIC16LF74-E/P
designator IC?
8-bit cmos flash microcontroller unit; Part Number: PIC16LF74-E/P; Component Kind: Standard; Component Type: Standard; Designator: PIC16LF74-E/P; Footprint: icv DIP40-600; Library Reference: PIC16LF74-E/P; Pin Count: 40
footprint icv DIP40-600
pins: 1, 2, 3, 4, 5, 6, 7, 8, 9, 10, 11, 12, 13, 14, 15, 16, 17, 18, 19, 20, 21, 22, 23, 24, 25, 26, 27, 28, 29, 30, 31, 32, 33, 34, 35, 36, 37, 38, 39, 40
text: 'MCLR'/VPP; RB7/PGD; RA0/AN0; RB6/PGC; RA1/AN1; RB5; RA2/AN2; RB4; RA3/AN3/VREF; RB3/PGM; RA4/T0CKI; RB2; RA5/AN4/'SS'; RB1; RE0/'RD'/AN5; RB0/INT; RE1/'WR'/AN6; VDD; RE2/'CS'/AN7; VSS; RD7/PSP7; RD6/PSP6; OSC1/CLKIN; RD5/PSP5; OSC2/CLKOUT; RD4/PSP4; RC0/T1OSO/T1CKI; RC7/RX/DT; RC1/T1OSI/CCP2; RC6/TX/CK; RC2/CCP1; RC5/SDO; RC3/SCK/SCL; RC4/SDI/SDA; RD0/PSP0; RD3/PSP3; RD1/PSP1; RD2/PSP2

## PIC16LF74-I/P
designator IC?
8-bit cmos flash microcontroller unit; Part Number: PIC16LF74-I/P; Component Kind: Standard; Component Type: Standard; Designator: PIC16LF74-I/P; Footprint: icv DIP40-600; Library Reference: PIC16LF74-I/P; Pin Count: 40
footprint icv DIP40-600
pins: 1, 2, 3, 4, 5, 6, 7, 8, 9, 10, 11, 12, 13, 14, 15, 16, 17, 18, 19, 20, 21, 22, 23, 24, 25, 26, 27, 28, 29, 30, 31, 32, 33, 34, 35, 36, 37, 38, 39, 40
text: 'MCLR'/VPP; RB7/PGD; RA0/AN0; RB6/PGC; RA1/AN1; RB5; RA2/AN2; RB4; RA3/AN3/VREF; RB3/PGM; RA4/T0CKI; RB2; RA5/AN4/'SS'; RB1; RE0/'RD'/AN5; RB0/INT; RE1/'WR'/AN6; VDD; RE2/'CS'/AN7; VSS; RD7/PSP7; RD6/PSP6; OSC1/CLKIN; RD5/PSP5; OSC2/CLKOUT; RD4/PSP4; RC0/T1OSO/T1CKI; RC7/RX/DT; RC1/T1OSI/CCP2; RC6/TX/CK; RC2/CCP1; RC5/SDO; RC3/SCK/SCL; RC4/SDI/SDA; RD0/PSP0; RD3/PSP3; RD1/PSP1; RD2/PSP2

## PIC16LF871-I/P
designator IC?
8-bit cmos flash microcontroller unit; Part Number: PIC16LF871-I/P; Component Kind: Standard; Component Type: Standard; Designator: PIC16LF871-I/P; Footprint: icv DIP40-600; Library Reference: PIC16LF871-I/P; Pin Count: 40
footprint icv DIP40-600
pins: 1, 2, 3, 4, 5, 6, 7, 8, 9, 10, 11, 12, 13, 14, 15, 16, 17, 18, 19, 20, 21, 22, 23, 24, 25, 26, 27, 28, 29, 30, 31, 32, 33, 34, 35, 36, 37, 38, 39, 40
text: 'MCLR'/VPP/THV; RB7/PGD; RA0/AN0; RB6/PGC; RA1/AN1; RB5; RA2/AN2/VREF-; RB4; RA3/AN3/VREF+; RB3/PGM; RA4/T0CKI; RB2; RA5/AN4; RB1; RE0/'RD'/AN5; RB0/INT; RE1/'WR'/AN6; VDD; RE2/'CS'/AN7; VSS; RD7/PSP7; RD6/PSP6; OSC1/CLKIN; RD5/PSP5; OSC2/CLKOUT; RD4/PSP4; RC0/T1OSO/T1CKI; RC7/RX/DT; RC1/T1OSI; RC6/TX/CK; RC2/CCP1; RC5; RC3; RC4; RD0/PSP0; RD3/PSP3; RD1/PSP1; RD2/PSP2

## PIC16LF874-E/P
designator IC?
8-bit cmos flash microcontroller unit; Part Number: PIC16LF874-E/P; Component Kind: Standard; Component Type: Standard; Designator: PIC16LF874-E/P; Footprint: icv DIP40-600; Library Reference: PIC16LF874-E/P; Pin Count: 40
footprint icv DIP40-600
pins: 1, 2, 3, 4, 5, 6, 7, 8, 9, 10, 11, 12, 13, 14, 15, 16, 17, 18, 19, 20, 21, 22, 23, 24, 25, 26, 27, 28, 29, 30, 31, 32, 33, 34, 35, 36, 37, 38, 39, 40
text: 'MCLR'/VPP; RB7/PGD; RA0/AN0; RB6/PGC; RA1/AN1; RB5; RA2/AN2/VREF-; RB4; RA3/AN3/VREF+; RB3/PGM; RA4/T0CKI; RB2; RA5/AN4/'SS'; RB1; RE0/'RD'/AN5; RB0/INT; RE1/'WR'/AN6; VDD; RE2/'CS'/AN7; VSS; RD7/PSP7; RD6/PSP6; OSC1/CLKIN; RD5/PSP5; OSC2/CLKOUT; RD4/PSP4; RC0/T1OSO/T1CKI; RC7/RX/DT; RC1/T1OSI/CCP2; RC6/TX/CK; RC2/CCP1; RC5/SDO; RC3/SCK/SCL; RC4/SDI/SDA; RD0/PSP0; RD3/PSP3; RD1/PSP1; RD2/PSP2

## PIC16LF874-I/P
designator IC?
8-bit cmos flash microcontroller unit; Part Number: PIC16LF874-I/P; Component Kind: Standard; Component Type: Standard; Designator: PIC16LF874-I/P; Footprint: icv DIP40-600; Library Reference: PIC16LF874-I/P; Pin Count: 40
footprint icv DIP40-600
pins: 1, 2, 3, 4, 5, 6, 7, 8, 9, 10, 11, 12, 13, 14, 15, 16, 17, 18, 19, 20, 21, 22, 23, 24, 25, 26, 27, 28, 29, 30, 31, 32, 33, 34, 35, 36, 37, 38, 39, 40
text: 'MCLR'/VPP; RB7/PGD; RA0/AN0; RB6/PGC; RA1/AN1; RB5; RA2/AN2/VREF-; RB4; RA3/AN3/VREF+; RB3/PGM; RA4/T0CKI; RB2; RA5/AN4/'SS'; RB1; RE0/'RD'/AN5; RB0/INT; RE1/'WR'/AN6; VDD; RE2/'CS'/AN7; VSS; RD7/PSP7; RD6/PSP6; OSC1/CLKIN; RD5/PSP5; OSC2/CLKOUT; RD4/PSP4; RC0/T1OSO/T1CKI; RC7/RX/DT; RC1/T1OSI/CCP2; RC6/TX/CK; RC2/CCP1; RC5/SDO; RC3/SCK/SCL; RC4/SDI/SDA; RD0/PSP0; RD3/PSP3; RD1/PSP1; RD2/PSP2

## PIC16LF1824-I/SL
designator IC?  (value not drawn)
MCU, 8BIT, 7K FLASH, 12 I/O
footprint smd SOICN/14
pins: 1 VDD, 2 RA5, 3 RA4, 4 RA3, 5 RC5, 6 RC4, 7 RC3, 8 RC2, 9 RC1, 10 RC0, 11 RA2, 12 RA1, 13 RA0, 14 VSS

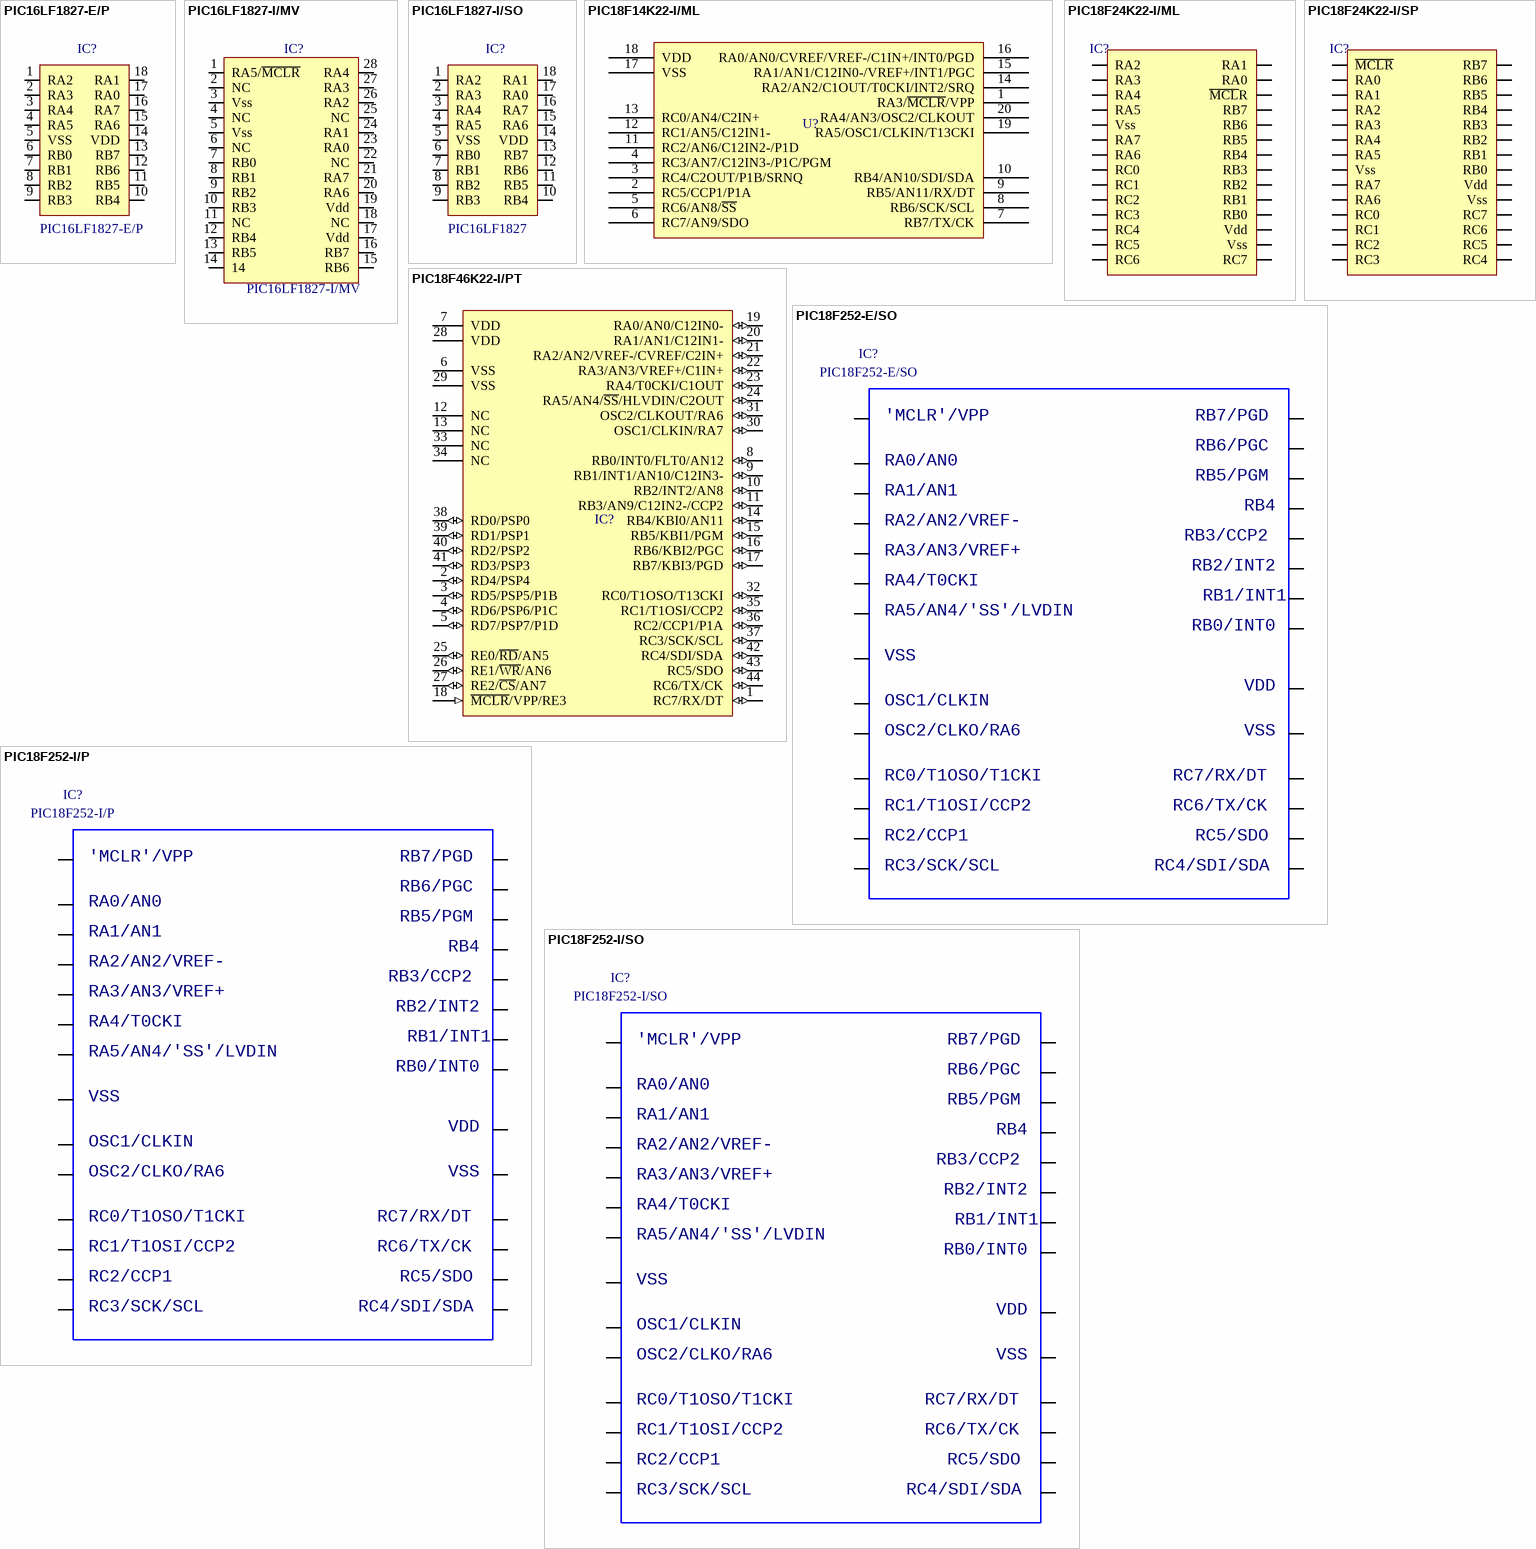
[diagram p166: symbols PIC16LF1827-E/P to PIC18F252-I/SO]

## PIC16LF1827-E/P
designator IC?
footprint icv DIP18-300
pins: 1 RA2, 2 RA3, 3 RA4, 4 RA5, 5 VSS, 6 RB0, 7 RB1, 8 RB2, 9 RB3, 10 RB4, 11 RB5, 12 RB6, 13 RB7, 14 VDD, 15 RA6, 16 RA7, 17 RA0, 18 RA1

## PIC16LF1827-I/MV
designator IC?
footprint SMD QFN/28 (6X6MM)
pins: 1 RA5/~{MCLR}, 2 NC, 3 Vss, 4 NC, 5 Vss, 6 NC, 7 RB0, 8 RB1, 9 RB2, 10 RB3, 11 NC, 12 RB4, 13 RB5, 14, 15 RB6, 16 RB7, 17 Vdd, 18 NC, 19 Vdd, 20 RA6, 21 RA7, 22 NC, 23 RA0, 24 RA1, 25 NC, 26 RA2, 27 RA3, 28 RA4

## PIC16LF1827-I/SO
designator IC?, comment PIC16LF1827
18/20/28-Pin Flash Microcontrollers  with nanoWatt XLP Technology
footprint smd SOICW/18
pins: 1 RA2, 2 RA3, 3 RA4, 4 RA5, 5 VSS, 6 RB0, 7 RB1, 8 RB2, 9 RB3, 10 RB4, 11 RB5, 12 RB6, 13 RB7, 14 VDD, 15 RA6, 16 RA7, 17 RA0, 18 RA1

## PIC18F14K22-I/ML
designator U?  (value not drawn)
20-Pin Flash Microcontrollers with nanoWatt XLP Technology
footprint smd QFN/20 (4x4mm p0.50mm)
pins: 1 RA3/~{MCLR}/VPP, 2 RC5/CCP1/P1A, 3 RC4/C2OUT/P1B/SRNQ, 4 RC3/AN7/C12IN3-/P1C/PGM, 5 RC6/AN8/~{SS}, 6 RC7/AN9/SDO, 7 RB7/TX/CK, 8 RB6/SCK/SCL, 9 RB5/AN11/RX/DT, 10 RB4/AN10/SDI/SDA, 11 RC2/AN6/C12IN2-/P1D, 12 RC1/AN5/C12IN1-, 13 RC0/AN4/C2IN+, 14 RA2/AN2/C1OUT/T0CKI/INT2/SRQ, 15 RA1/AN1/C12IN0-/VREF+/INT1/PGC, 16 RA0/AN0/CVREF/VREF-/C1IN+/INT0/PGD, 17 VSS, 18 VDD, 19 RA5/OSC1/CLKIN/T13CKI, 20 RA4/AN3/OSC2/CLKOUT

## PIC18F24K22-I/ML
designator IC?  (value not drawn)
High-Performance Microcontrollers  with nanoWatt XLP Technology
footprint smd QFN/28 (6x6mm)
pins: 1 RA2, 2 RA3, 3 RA4, 4 RA5, 5 Vss, 6 RA7, 7 RA6, 8 RC0, 9 RC1, 10 RC2, 11 RC3, 12 RC4, 13 RC5, 14 RC6, 15 RC7, 16 Vss, 17 Vdd, 18 RB0, 19 RB1, 20 RB2, 21 RB3, 22 RB4, 23 RB5, 24 RB6, 25 RB7, 26 ~{MCL}R, 27 RA0, 28 RA1

## PIC18F24K22-I/SP
designator IC?  (value not drawn)
High-Performance Microcontrollers  with nanoWatt XLP Technology
footprint icv DIP28-300
pins: 1 ~{MCLR}, 2 RA0, 3 RA1, 4 RA2, 5 RA3, 6 RA4, 7 RA5, 8 Vss, 9 RA7, 10 RA6, 11 RC0, 12 RC1, 13 RC2, 14 RC3, 15 RC4, 16 RC5, 17 RC6, 18 RC7, 19 Vss, 20 Vdd, 21 RB0, 22 RB1, 23 RB2, 24 RB3, 25 RB4, 26 RB5, 27 RB6, 28 RB7

## PIC18F46K22-I/PT
designator IC?  (value not drawn)
footprint smd TQFP/44
pins: 1 RC7/RX/DT (io), 2 RD4/PSP4 (io), 3 RD5/PSP5/P1B (io), 4 RD6/PSP6/P1C (io), 5 RD7/PSP7/P1D (io), 6 VSS (power), 7 VDD (power), 8 RB0/INT0/FLT0/AN12 (io), 9 RB1/INT1/AN10/C12IN3- (io), 10 RB2/INT2/AN8 (io), 11 RB3/AN9/C12IN2-/CCP2 (io), 12 NC, 13 NC, 14 RB4/KBI0/AN11 (io), 15 RB5/KBI1/PGM (io), 16 RB6/KBI2/PGC (io), 17 RB7/KBI3/PGD (io), 18 ~{MCLR}/VPP/RE3 (in), 19 RA0/AN0/C12IN0- (io), 20 RA1/AN1/C12IN1- (io), 21 RA2/AN2/VREF-/CVREF/C2IN+ (io), 22 RA3/AN3/VREF+/C1IN+ (io), 23 RA4/T0CKI/C1OUT (io), 24 RA5/AN4/~{SS}/HLVDIN/C2OUT (io), 25 RE0/~{RD}/AN5 (io), 26 RE1/~{WR}/AN6 (io), 27 RE2/~{CS}/AN7 (io), 28 VDD (power), 29 VSS (power), 30 OSC1/CLKIN/RA7 (io), 31 OSC2/CLKOUT/RA6 (io), 32 RC0/T1OSO/T13CKI (io), 33 NC, 34 NC, 35 RC1/T1OSI/CCP2 (io), 36 RC2/CCP1/P1A (io), 37 RC3/SCK/SCL (io), 38 RD0/PSP0 (io), 39 RD1/PSP1 (io), 40 RD2/PSP2 (io), 41 RD3/PSP3 (io), 42 RC4/SDI/SDA (io), 43 RC5/SDO (io), 44 RC6/TX/CK (io)

## PIC18F252-E/SO
designator IC?
high performance enhanced flash microcontroller, 10-bit A/D; Part Number: PIC18F252-E/SO; Component Kind: Standard; Component Type: Standard; Designator: PIC18F252-E/SO; Footprint: smd SOICW/28; Library Reference: PIC18F252-E/SO; Pin Count: 28
footprint smd SOICW/28
pins: 1, 2, 3, 4, 5, 6, 7, 8, 9, 10, 11, 12, 13, 14, 15, 16, 17, 18, 19, 20, 21, 22, 23, 24, 25, 26, 27, 28
text: 'MCLR'/VPP; RB7/PGD; RB6/PGC; RA0/AN0; RB5/PGM; RA1/AN1; RB4; RA2/AN2/VREF-; RB3/CCP2; RA3/AN3/VREF+; RB2/INT2; RA4/T0CKI; RB1/INT1; RA5/AN4/'SS'/LVDIN; RB0/INT0; VSS; VDD; OSC1/CLKIN; OSC2/CLKO/RA6; RC0/T1OSO/T1CKI; RC7/RX/DT; RC1/T1OSI/CCP2; RC6/TX/CK; RC2/CCP1; RC5/SDO; RC3/SCK/SCL; RC4/SDI/SDA

## PIC18F252-I/P
designator IC?
high performance enhanced flash microcontroller, 10-bit A/D
footprint icv DIP28-300
pins: 1, 2, 3, 4, 5, 6, 7, 8, 9, 10, 11, 12, 13, 14, 15, 16, 17, 18, 19, 20, 21, 22, 23, 24, 25, 26, 27, 28
text: 'MCLR'/VPP; RB7/PGD; RB6/PGC; RA0/AN0; RB5/PGM; RA1/AN1; RB4; RA2/AN2/VREF-; RB3/CCP2; RA3/AN3/VREF+; RB2/INT2; RA4/T0CKI; RB1/INT1; RA5/AN4/'SS'/LVDIN; RB0/INT0; VSS; VDD; OSC1/CLKIN; OSC2/CLKO/RA6; RC0/T1OSO/T1CKI; RC7/RX/DT; RC1/T1OSI/CCP2; RC6/TX/CK; RC2/CCP1; RC5/SDO; RC3/SCK/SCL; RC4/SDI/SDA

## PIC18F252-I/SO
designator IC?
high performance enhanced flash microcontroller, 10-bit A/D
footprint smd SOICW/28
pins: 1, 2, 3, 4, 5, 6, 7, 8, 9, 10, 11, 12, 13, 14, 15, 16, 17, 18, 19, 20, 21, 22, 23, 24, 25, 26, 27, 28
text: 'MCLR'/VPP; RB7/PGD; RB6/PGC; RA0/AN0; RB5/PGM; RA1/AN1; RB4; RA2/AN2/VREF-; RB3/CCP2; RA3/AN3/VREF+; RB2/INT2; RA4/T0CKI; RB1/INT1; RA5/AN4/'SS'/LVDIN; RB0/INT0; VSS; VDD; OSC1/CLKIN; OSC2/CLKO/RA6; RC0/T1OSO/T1CKI; RC7/RX/DT; RC1/T1OSI/CCP2; RC6/TX/CK; RC2/CCP1; RC5/SDO; RC3/SCK/SCL; RC4/SDI/SDA

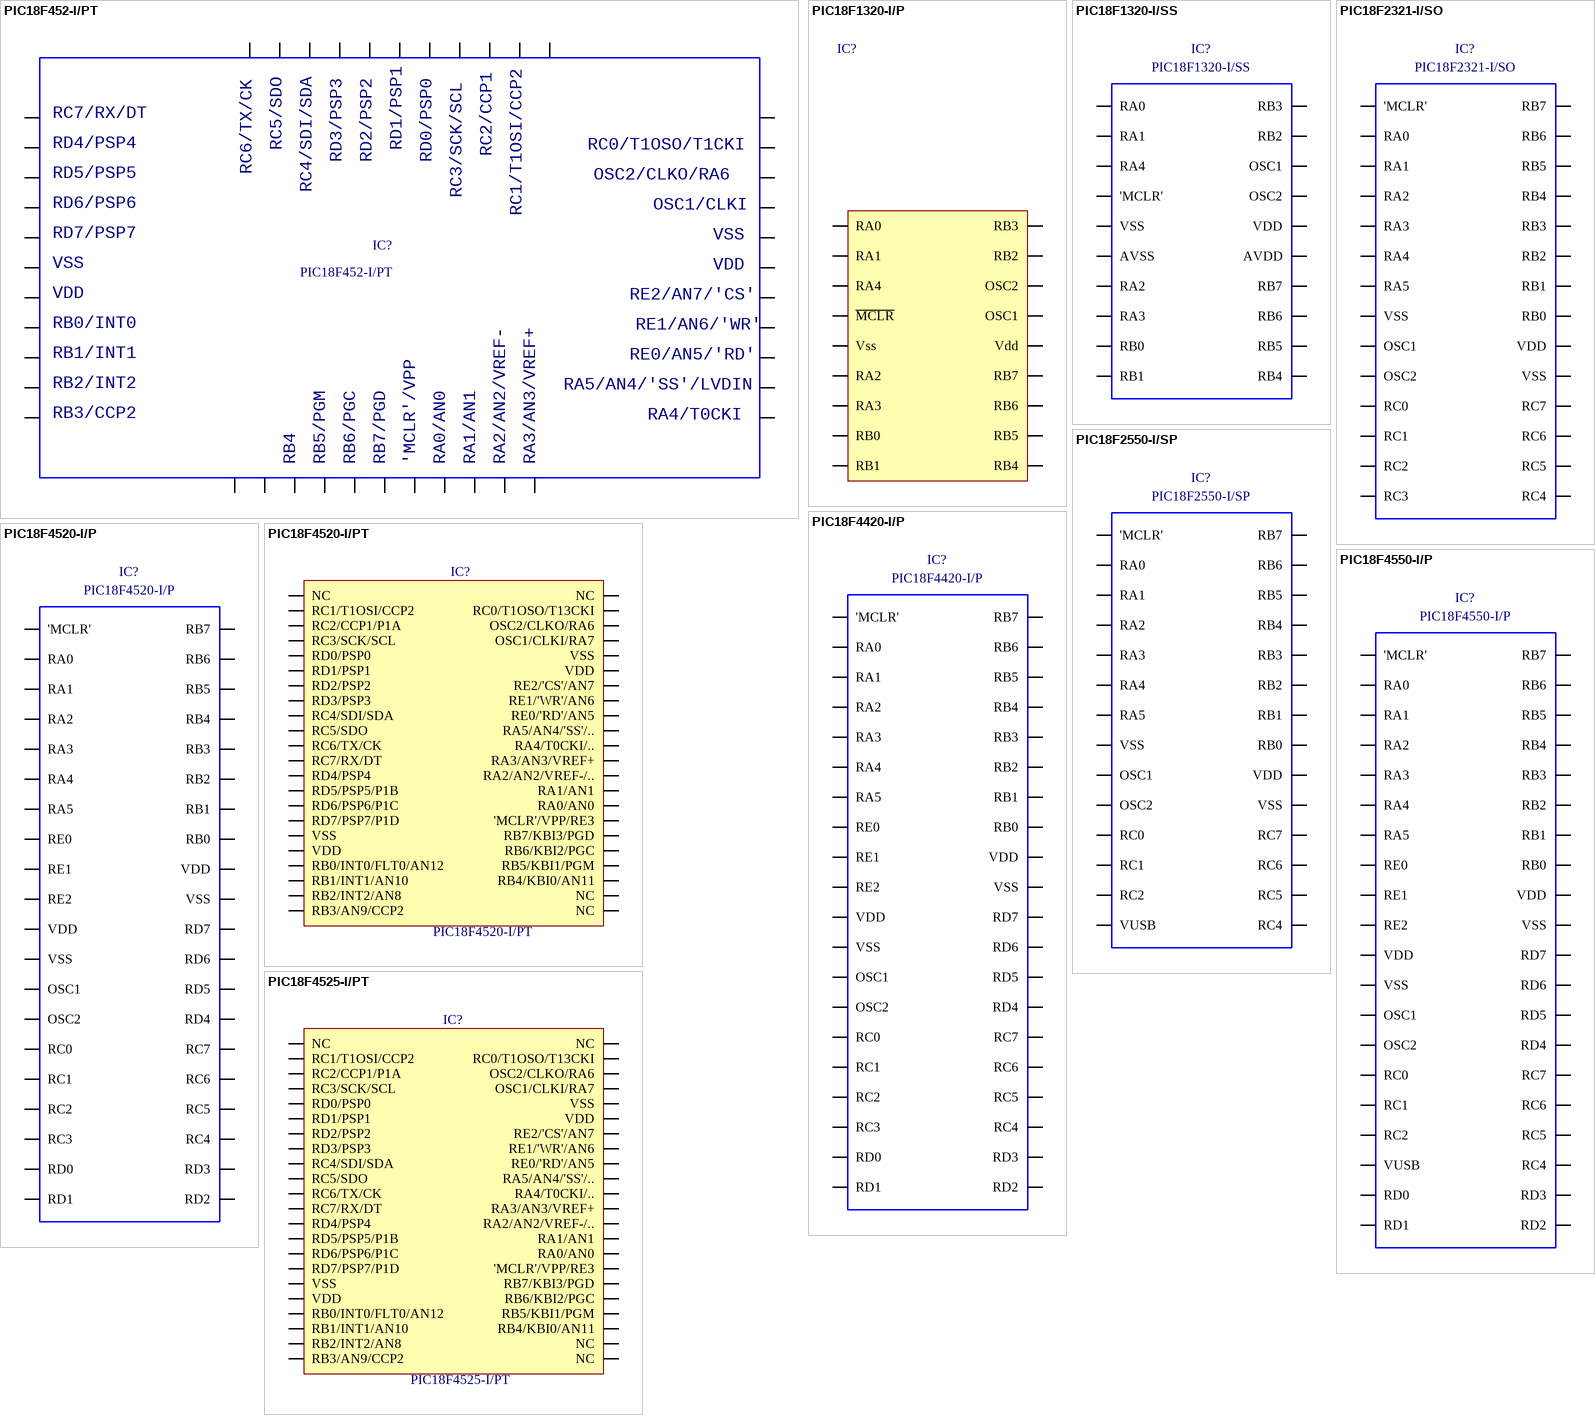
[diagram p167: symbols PIC18F452-I/PT to PIC18F4550-I/P]

## PIC18F452-I/PT
designator IC?
high performance enhanced flash microcontroller, 10-bit A/D
footprint smd TQFP/44
pins: 1, 2, 3, 4, 5, 6, 7, 8, 9, 10, 11, 12, 13, 14, 15, 16, 17, 18, 19, 20, 21, 22, 23, 24, 25, 26, 27, 28, 29, 30, 31, 32, 33, 34, 35, 36, 37, 38, 39, 40, 41, 42, 43, 44
text: RC7/RX/DT; RC5/SDO; RD1/PSP1; RD4/PSP4; RC2/CCP1; RC0/T1OSO/T1CKI; RD3/PSP3; RD2/PSP2; RD0/PSP0; RC6/TX/CK; RD5/PSP5; OSC2/CLKO/RA6; RC4/SDI/SDA; RC3/SCK/SCL; RD6/PSP6; RC1/T1OSI/CCP2; OSC1/CLKI; RD7/PSP7; VSS; VDD; RE2/AN7/'CS'; RB0/INT0; RE1/AN6/'WR'; RB1/INT1; RE0/AN5/'RD'; RB2/INT2; RA5/AN4/'SS'/LVDIN; RB3/CCP2; RA4/T0CKI; RB4; RB5/PGM; RB6/PGC; RB7/PGD; 'MCLR'/VPP; RA0/AN0; RA1/AN1; RA2/AN2/VREF-; RA3/AN3/VREF+

## PIC18F1320-I/P
designator IC?  (value not drawn)
high performance enhanced flash microcontroller, 10-bit A/D
footprint icv DIP18-300
pins: 1 RA0, 2 RA1, 3 RA4, 4 ~{MCLR}, 5 Vss, 6 RA2, 7 RA3, 8 RB0, 9 RB1, 10 RB4, 11 RB5, 12 RB6, 13 RB7, 14 Vdd, 15 OSC1, 16 OSC2, 17 RB2, 18 RB3

## PIC18F1320-I/SS
designator IC?
high performance enhanced flash microcontroller, 10-bit A/D
footprint smd SSOP/20 (body 5.3 pitch 0.65)
pins: 1 RA0, 2 RA1, 3 RA4, 4 'MCLR', 5 VSS, 6 AVSS, 7 RA2, 8 RA3, 9 RB0, 10 RB1, 11 RB4, 12 RB5, 13 RB6, 14 RB7, 15 AVDD, 16 VDD, 17 OSC2, 18 OSC1, 19 RB2, 20 RB3

## PIC18F2321-I/SO
designator IC?
Enhanced Flash Microcontrollers with 10-Bit A/D
footprint smd SOICW/28
pins: 1 'MCLR', 2 RA0, 3 RA1, 4 RA2, 5 RA3, 6 RA4, 7 RA5, 8 VSS, 9 OSC1, 10 OSC2, 11 RC0, 12 RC1, 13 RC2, 14 RC3, 15 RC4, 16 RC5, 17 RC6, 18 RC7, 19 VSS, 20 VDD, 21 RB0, 22 RB1, 23 RB2, 24 RB3, 25 RB4, 26 RB5, 27 RB6, 28 RB7

## PIC18F2550-I/SP
designator IC?
high-performance enhanced flash microcontroller
footprint icv DIP28-300
pins: 1 'MCLR', 2 RA0, 3 RA1, 4 RA2, 5 RA3, 6 RA4, 7 RA5, 8 VSS, 9 OSC1, 10 OSC2, 11 RC0, 12 RC1, 13 RC2, 14 VUSB, 15 RC4, 16 RC5, 17 RC6, 18 RC7, 19 VSS, 20 VDD, 21 RB0, 22 RB1, 23 RB2, 24 RB3, 25 RB4, 26 RB5, 27 RB6, 28 RB7

## PIC18F4420-I/P
designator IC?
enhanced flash microcontrollers with 10-Bit A/D
footprint icv DIP40-600
pins: 1 'MCLR', 2 RA0, 3 RA1, 4 RA2, 5 RA3, 6 RA4, 7 RA5, 8 RE0, 9 RE1, 10 RE2, 11 VDD, 12 VSS, 13 OSC1, 14 OSC2, 15 RC0, 16 RC1, 17 RC2, 18 RC3, 19 RD0, 20 RD1, 21 RD2, 22 RD3, 23 RC4, 24 RC5, 25 RC6, 26 RC7, 27 RD4, 28 RD5, 29 RD6, 30 RD7, 31 VSS, 32 VDD, 33 RB0, 34 RB1, 35 RB2, 36 RB3, 37 RB4, 38 RB5, 39 RB6, 40 RB7

## PIC18F4520-I/P
designator IC?
enhanced flash microcontrollers with 10-Bit A/D; Part Number: PIC18F4520-I/P; Component Kind: Standard; Component Type: Standard; Designator: PIC18F4520-I/P; Footprint: icv DIP40-600; Library Reference: PIC18F4520-I/P; Pin Count: 40
footprint icv DIP40-600
pins: 1 'MCLR', 2 RA0, 3 RA1, 4 RA2, 5 RA3, 6 RA4, 7 RA5, 8 RE0, 9 RE1, 10 RE2, 11 VDD, 12 VSS, 13 OSC1, 14 OSC2, 15 RC0, 16 RC1, 17 RC2, 18 RC3, 19 RD0, 20 RD1, 21 RD2, 22 RD3, 23 RC4, 24 RC5, 25 RC6, 26 RC7, 27 RD4, 28 RD5, 29 RD6, 30 RD7, 31 VSS, 32 VDD, 33 RB0, 34 RB1, 35 RB2, 36 RB3, 37 RB4, 38 RB5, 39 RB6, 40 RB7

## PIC18F4520-I/PT
designator IC?
high-performance flash microcontrollers with A/D; Part Number: PIC18F4520-I/PT; Component Kind: Standard; Component Type: Standard; Designator: PIC18F4520-I/PT; Footprint: smd TQFP/44; Library Reference: PIC18F4520-I/PT; Pin Count: 44
footprint smd TQFP/44
pins: 1 RC7/RX/DT, 2 RD4/PSP4, 3 RD5/PSP5/P1B, 4 RD6/PSP6/P1C, 5 RD7/PSP7/P1D, 6 VSS, 7 VDD, 8 RB0/INT0/FLT0/AN12, 9 RB1/INT1/AN10, 10 RB2/INT2/AN8, 11 RB3/AN9/CCP2, 12 NC, 13 NC, 14 RB4/KBI0/AN11, 15 RB5/KBI1/PGM, 16 RB6/KBI2/PGC, 17 RB7/KBI3/PGD, 18 'MCLR'/VPP/RE3, 19 RA0/AN0, 20 RA1/AN1, 21 RA2/AN2/VREF-/.., 22 RA3/AN3/VREF+, 23 RA4/T0CKI/.., 24 RA5/AN4/'SS'/.., 25 RE0/'RD'/AN5, 26 RE1/'WR'/AN6, 27 RE2/'CS'/AN7, 28 VDD, 29 VSS, 30 OSC1/CLKI/RA7, 31 OSC2/CLKO/RA6, 32 RC0/T1OSO/T13CKI, 33 NC, 34 NC, 35 RC1/T1OSI/CCP2, 36 RC2/CCP1/P1A, 37 RC3/SCK/SCL, 38 RD0/PSP0, 39 RD1/PSP1, 40 RD2/PSP2, 41 RD3/PSP3, 42 RC4/SDI/SDA, 43 RC5/SDO, 44 RC6/TX/CK

## PIC18F4525-I/PT
designator IC?
enhanced flash microcontrollers with 10-Bit A/D; Part Number: PIC18F4525-I/PT; Component Kind: Standard; Component Type: Standard; Designator: PIC18F4525-I/PT; Footprint: smd TQFP/44; Library Reference: PIC18F4525-I/PT; Pin Count: 44
footprint smd TQFP/44
pins: 1 RC7/RX/DT, 2 RD4/PSP4, 3 RD5/PSP5/P1B, 4 RD6/PSP6/P1C, 5 RD7/PSP7/P1D, 6 VSS, 7 VDD, 8 RB0/INT0/FLT0/AN12, 9 RB1/INT1/AN10, 10 RB2/INT2/AN8, 11 RB3/AN9/CCP2, 12 NC, 13 NC, 14 RB4/KBI0/AN11, 15 RB5/KBI1/PGM, 16 RB6/KBI2/PGC, 17 RB7/KBI3/PGD, 18 'MCLR'/VPP/RE3, 19 RA0/AN0, 20 RA1/AN1, 21 RA2/AN2/VREF-/.., 22 RA3/AN3/VREF+, 23 RA4/T0CKI/.., 24 RA5/AN4/'SS'/.., 25 RE0/'RD'/AN5, 26 RE1/'WR'/AN6, 27 RE2/'CS'/AN7, 28 VDD, 29 VSS, 30 OSC1/CLKI/RA7, 31 OSC2/CLKO/RA6, 32 RC0/T1OSO/T13CKI, 33 NC, 34 NC, 35 RC1/T1OSI/CCP2, 36 RC2/CCP1/P1A, 37 RC3/SCK/SCL, 38 RD0/PSP0, 39 RD1/PSP1, 40 RD2/PSP2, 41 RD3/PSP3, 42 RC4/SDI/SDA, 43 RC5/SDO, 44 RC6/TX/CK

## PIC18F4550-I/P
designator IC?
enhanced flash USB microcontrollers
footprint icv DIP40-600
pins: 1 'MCLR', 2 RA0, 3 RA1, 4 RA2, 5 RA3, 6 RA4, 7 RA5, 8 RE0, 9 RE1, 10 RE2, 11 VDD, 12 VSS, 13 OSC1, 14 OSC2, 15 RC0, 16 RC1, 17 RC2, 18 VUSB, 19 RD0, 20 RD1, 21 RD2, 22 RD3, 23 RC4, 24 RC5, 25 RC6, 26 RC7, 27 RD4, 28 RD5, 29 RD6, 30 RD7, 31 VSS, 32 VDD, 33 RB0, 34 RB1, 35 RB2, 36 RB3, 37 RB4, 38 RB5, 39 RB6, 40 RB7

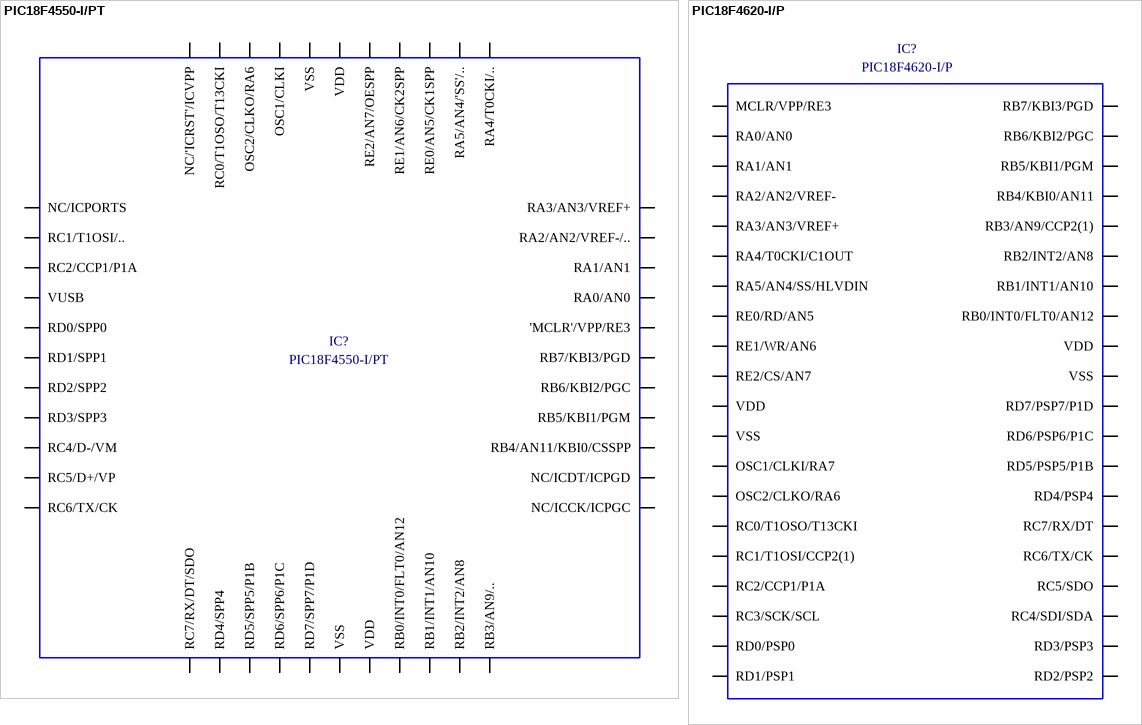
[diagram p168: symbols PIC18F4550-I/PT to PIC18F4620-I/P]

## PIC18F4550-I/PT
designator IC?
enhanced flash USB microcontrollers
footprint smd TQFP/44
pins: 1 RC7/RX/DT/SDO, 2 RD4/SPP4, 3 RD5/SPP5/P1B, 4 RD6/SPP6/P1C, 5 RD7/SPP7/P1D, 6 VSS, 7 VDD, 8 RB0/INT0/FLT0/AN12, 9 RB1/INT1/AN10, 10 RB2/INT2/AN8, 11 RB3/AN9/.., 12 NC/ICCK/ICPGC, 13 NC/ICDT/ICPGD, 14 RB4/AN11/KBI0/CSSPP, 15 RB5/KBI1/PGM, 16 RB6/KBI2/PGC, 17 RB7/KBI3/PGD, 18 'MCLR'/VPP/RE3, 19 RA0/AN0, 20 RA1/AN1, 21 RA2/AN2/VREF-/.., 22 RA3/AN3/VREF+, 23 RA4/T0CKI/.., 24 RA5/AN4/'SS'/.., 25 RE0/AN5/CK1SPP, 26 RE1/AN6/CK2SPP, 27 RE2/AN7/OESPP, 28 VDD, 29 VSS, 30 OSC1/CLKI, 31 OSC2/CLKO/RA6, 32 RC0/T1OSO/T13CKI, 33 NC/'ICRST'/ICVPP, 34 NC/ICPORTS, 35 RC1/T1OSI/.., 36 RC2/CCP1/P1A, 37 VUSB, 38 RD0/SPP0, 39 RD1/SPP1, 40 RD2/SPP2, 41 RD3/SPP3, 42 RC4/D-/VM, 43 RC5/D+/VP, 44 RC6/TX/CK

## PIC18F4620-I/P
designator IC?
Enhanced Flash Microcontrollers with 10-Bit A/D
footprint icv DIP40-600
pins: 1 MCLR/VPP/RE3, 2 RA0/AN0, 3 RA1/AN1, 4 RA2/AN2/VREF-, 5 RA3/AN3/VREF+, 6 RA4/T0CKI/C1OUT, 7 RA5/AN4/SS/HLVDIN, 8 RE0/RD/AN5, 9 RE1/WR/AN6, 10 RE2/CS/AN7, 11 VDD, 12 VSS, 13 OSC1/CLKI/RA7, 14 OSC2/CLKO/RA6, 15 RC0/T1OSO/T13CKI, 16 RC1/T1OSI/CCP2(1), 17 RC2/CCP1/P1A, 18 RC3/SCK/SCL, 19 RD0/PSP0, 20 RD1/PSP1, 21 RD2/PSP2, 22 RD3/PSP3, 23 RC4/SDI/SDA, 24 RC5/SDO, 25 RC6/TX/CK, 26 RC7/RX/DT, 27 RD4/PSP4, 28 RD5/PSP5/P1B, 29 RD6/PSP6/P1C, 30 RD7/PSP7/P1D, 31 VSS, 32 VDD, 33 RB0/INT0/FLT0/AN12, 34 RB1/INT1/AN10, 35 RB2/INT2/AN8, 36 RB3/AN9/CCP2(1), 37 RB4/KBI0/AN11, 38 RB5/KBI1/PGM, 39 RB6/KBI2/PGC, 40 RB7/KBI3/PGD

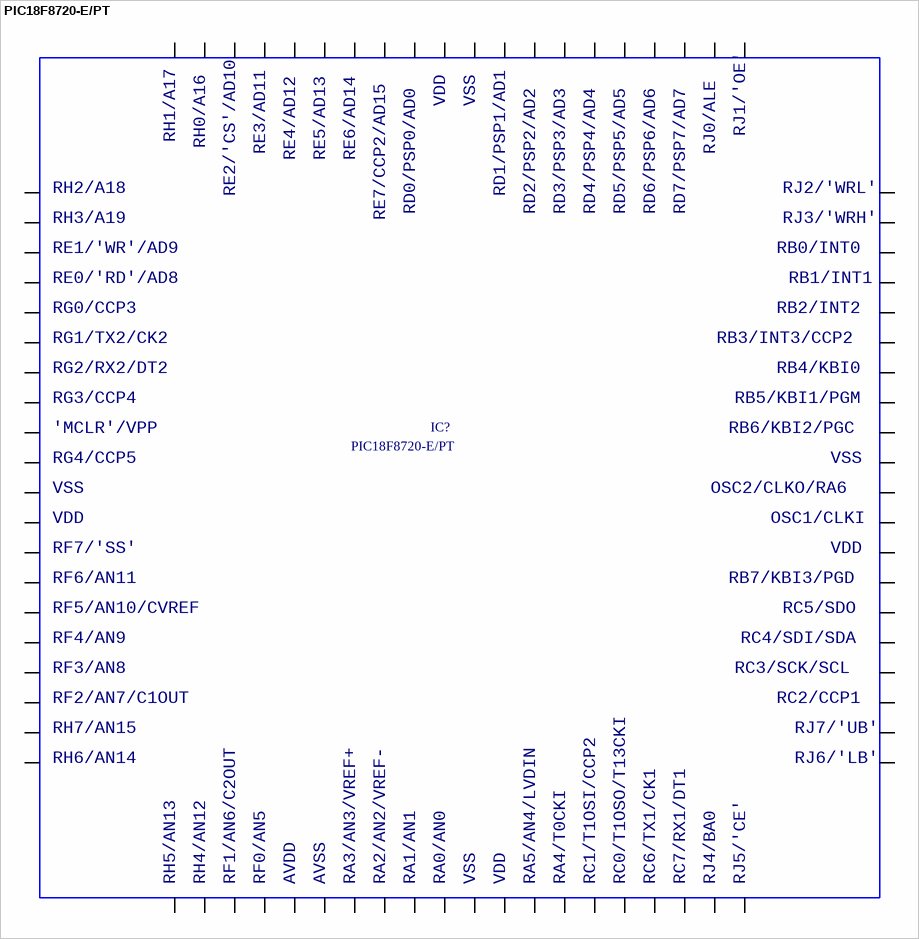
[diagram p169: symbol PIC18F8720-E/PT]

## PIC18F8720-E/PT
designator IC?
high-performance flash microcontrollers with A/D; Part Number: PIC18F8720-E/PT; Component Kind: Standard; Component Type: Standard; Designator: PIC18F8720-E/PT; Footprint: smd TQFP/80; Library Reference: PIC18F8720-E/PT; Pin Count: 80
footprint smd TQFP/80
pins: 1, 2, 3, 4, 5, 6, 7, 8, 9, 10, 11, 12, 13, 14, 15, 16, 17, 18, 19, 20, 21, 22, 23, 24, 25, 26, 27, 28, 29, 30, 31, 32, 33, 34, 35, 36, 37, 38, 39, 40, 41, 42, 43, 44, 45, 46, 47, 48, 49, 50, 51, 52, 53, 54, 55, 56, 57, 58, 59, 60, 61, 62, 63, 64, 65, 66, 67, 68, 69, 70, 71, 72, 73, 74, 75, 76, 77, 78, 79, 80
text: VDD; VSS; RH1/A17; RJ1/'OE'; RH0/A16; RE3/AD11; RJ0/ALE; RE4/AD12; RE5/AD13; RE6/AD14; RH2/A18; RE2/'CS'/AD10; RD1/PSP1/AD1; RJ2/'WRL'; RD0/PSP0/AD0; RD2/PSP2/AD2; RD3/PSP3/AD3; RD4/PSP4/AD4; RD5/PSP5/AD5; RD6/PSP6/AD6; RD7/PSP7/AD7; RE7/CCP2/AD15; RH3/A19; RJ3/'WRH'; RE1/'WR'/AD9; RB0/INT0; RE0/'RD'/AD8; RB1/INT1; RG0/CCP3; RB2/INT2; RG1/TX2/CK2; RB3/INT3/CCP2; RG2/RX2/DT2; RB4/KBI0; RG3/CCP4; RB5/KBI1/PGM; 'MCLR'/VPP; RB6/KBI2/PGC; RG4/CCP5; OSC2/CLKO/RA6; OSC1/CLKI; RF7/'SS'; RF6/AN11; RB7/KBI3/PGD; RF5/AN10/CVREF; RC5/SDO; RF4/AN9; RC4/SDI/SDA; RF3/AN8; RC3/SCK/SCL; RF2/AN7/C1OUT; RC2/CCP1; RH7/AN15; RJ7/'UB'; RH6/AN14; RJ6/'LB'; RH5/AN13; RH4/AN12; RF1/AN6/C2OUT; RF0/AN5; AVDD; AVSS; RA3/AN3/VREF+; RA2/AN2/VREF-; RA1/AN1; RA0/AN0; RA5/AN4/LVDIN; RA4/T0CKI; RC1/T1OSI/CCP2; RC0/T1OSO/T13CKI; RC6/TX1/CK1; RC7/RX1/DT1; RJ4/BA0; RJ5/'CE'

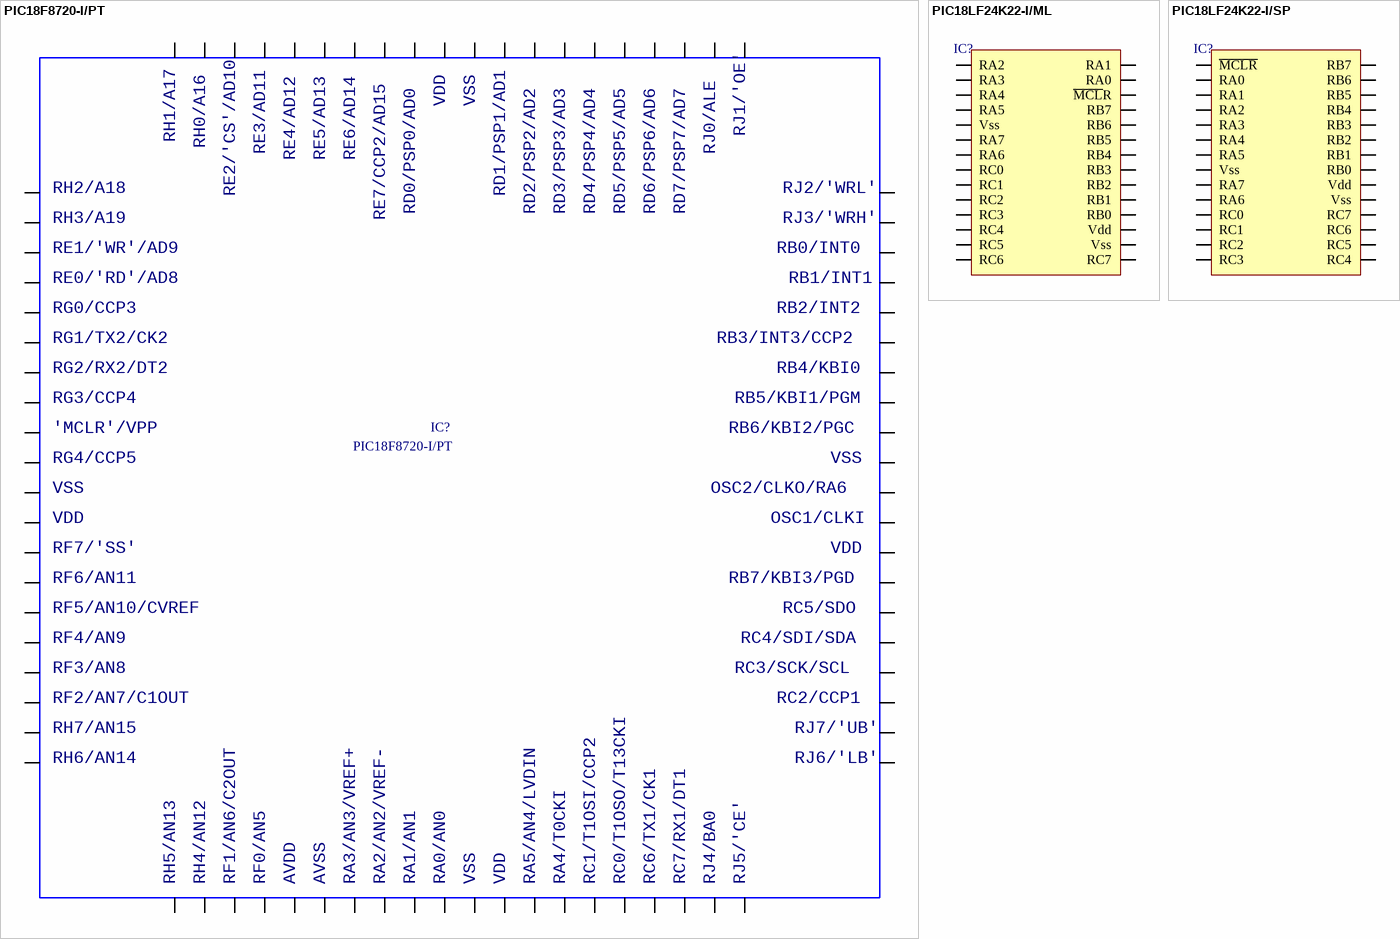
[diagram p170: symbols PIC18F8720-I/PT to PIC18LF24K22-I/SP]

## PIC18F8720-I/PT
designator IC?
high-performance flash microcontrollers with A/D
footprint smd TQFP/80
pins: 1, 2, 3, 4, 5, 6, 7, 8, 9, 10, 11, 12, 13, 14, 15, 16, 17, 18, 19, 20, 21, 22, 23, 24, 25, 26, 27, 28, 29, 30, 31, 32, 33, 34, 35, 36, 37, 38, 39, 40, 41, 42, 43, 44, 45, 46, 47, 48, 49, 50, 51, 52, 53, 54, 55, 56, 57, 58, 59, 60, 61, 62, 63, 64, 65, 66, 67, 68, 69, 70, 71, 72, 73, 74, 75, 76, 77, 78, 79, 80
text: VDD; VSS; RH1/A17; RJ1/'OE'; RH0/A16; RE3/AD11; RJ0/ALE; RE4/AD12; RE5/AD13; RE6/AD14; RH2/A18; RE2/'CS'/AD10; RD1/PSP1/AD1; RJ2/'WRL'; RD0/PSP0/AD0; RD2/PSP2/AD2; RD3/PSP3/AD3; RD4/PSP4/AD4; RD5/PSP5/AD5; RD6/PSP6/AD6; RD7/PSP7/AD7; RE7/CCP2/AD15; RH3/A19; RJ3/'WRH'; RE1/'WR'/AD9; RB0/INT0; RE0/'RD'/AD8; RB1/INT1; RG0/CCP3; RB2/INT2; RG1/TX2/CK2; RB3/INT3/CCP2; RG2/RX2/DT2; RB4/KBI0; RG3/CCP4; RB5/KBI1/PGM; 'MCLR'/VPP; RB6/KBI2/PGC; RG4/CCP5; OSC2/CLKO/RA6; OSC1/CLKI; RF7/'SS'; RF6/AN11; RB7/KBI3/PGD; RF5/AN10/CVREF; RC5/SDO; RF4/AN9; RC4/SDI/SDA; RF3/AN8; RC3/SCK/SCL; RF2/AN7/C1OUT; RC2/CCP1; RH7/AN15; RJ7/'UB'; RH6/AN14; RJ6/'LB'; RH5/AN13; RH4/AN12; RF1/AN6/C2OUT; RF0/AN5; AVDD; AVSS; RA3/AN3/VREF+; RA2/AN2/VREF-; RA1/AN1; RA0/AN0; RA5/AN4/LVDIN; RA4/T0CKI; RC1/T1OSI/CCP2; RC0/T1OSO/T13CKI; RC6/TX1/CK1; RC7/RX1/DT1; RJ4/BA0; RJ5/'CE'

## PIC18LF24K22-I/ML
designator IC?  (value not drawn)
High-Performance Microcontrollers  with nanoWatt XLP Technology
footprint smd QFN/28 (6x6mm)
pins: 1 RA2, 2 RA3, 3 RA4, 4 RA5, 5 Vss, 6 RA7, 7 RA6, 8 RC0, 9 RC1, 10 RC2, 11 RC3, 12 RC4, 13 RC5, 14 RC6, 15 RC7, 16 Vss, 17 Vdd, 18 RB0, 19 RB1, 20 RB2, 21 RB3, 22 RB4, 23 RB5, 24 RB6, 25 RB7, 26 ~{MCL}R, 27 RA0, 28 RA1

## PIC18LF24K22-I/SP
designator IC?  (value not drawn)
High-Performance Microcontrollers  with nanoWatt XLP Technology
footprint icv DIP28-300
pins: 1 ~{MCLR}, 2 RA0, 3 RA1, 4 RA2, 5 RA3, 6 RA4, 7 RA5, 8 Vss, 9 RA7, 10 RA6, 11 RC0, 12 RC1, 13 RC2, 14 RC3, 15 RC4, 16 RC5, 17 RC6, 18 RC7, 19 Vss, 20 Vdd, 21 RB0, 22 RB1, 23 RB2, 24 RB3, 25 RB4, 26 RB5, 27 RB6, 28 RB7

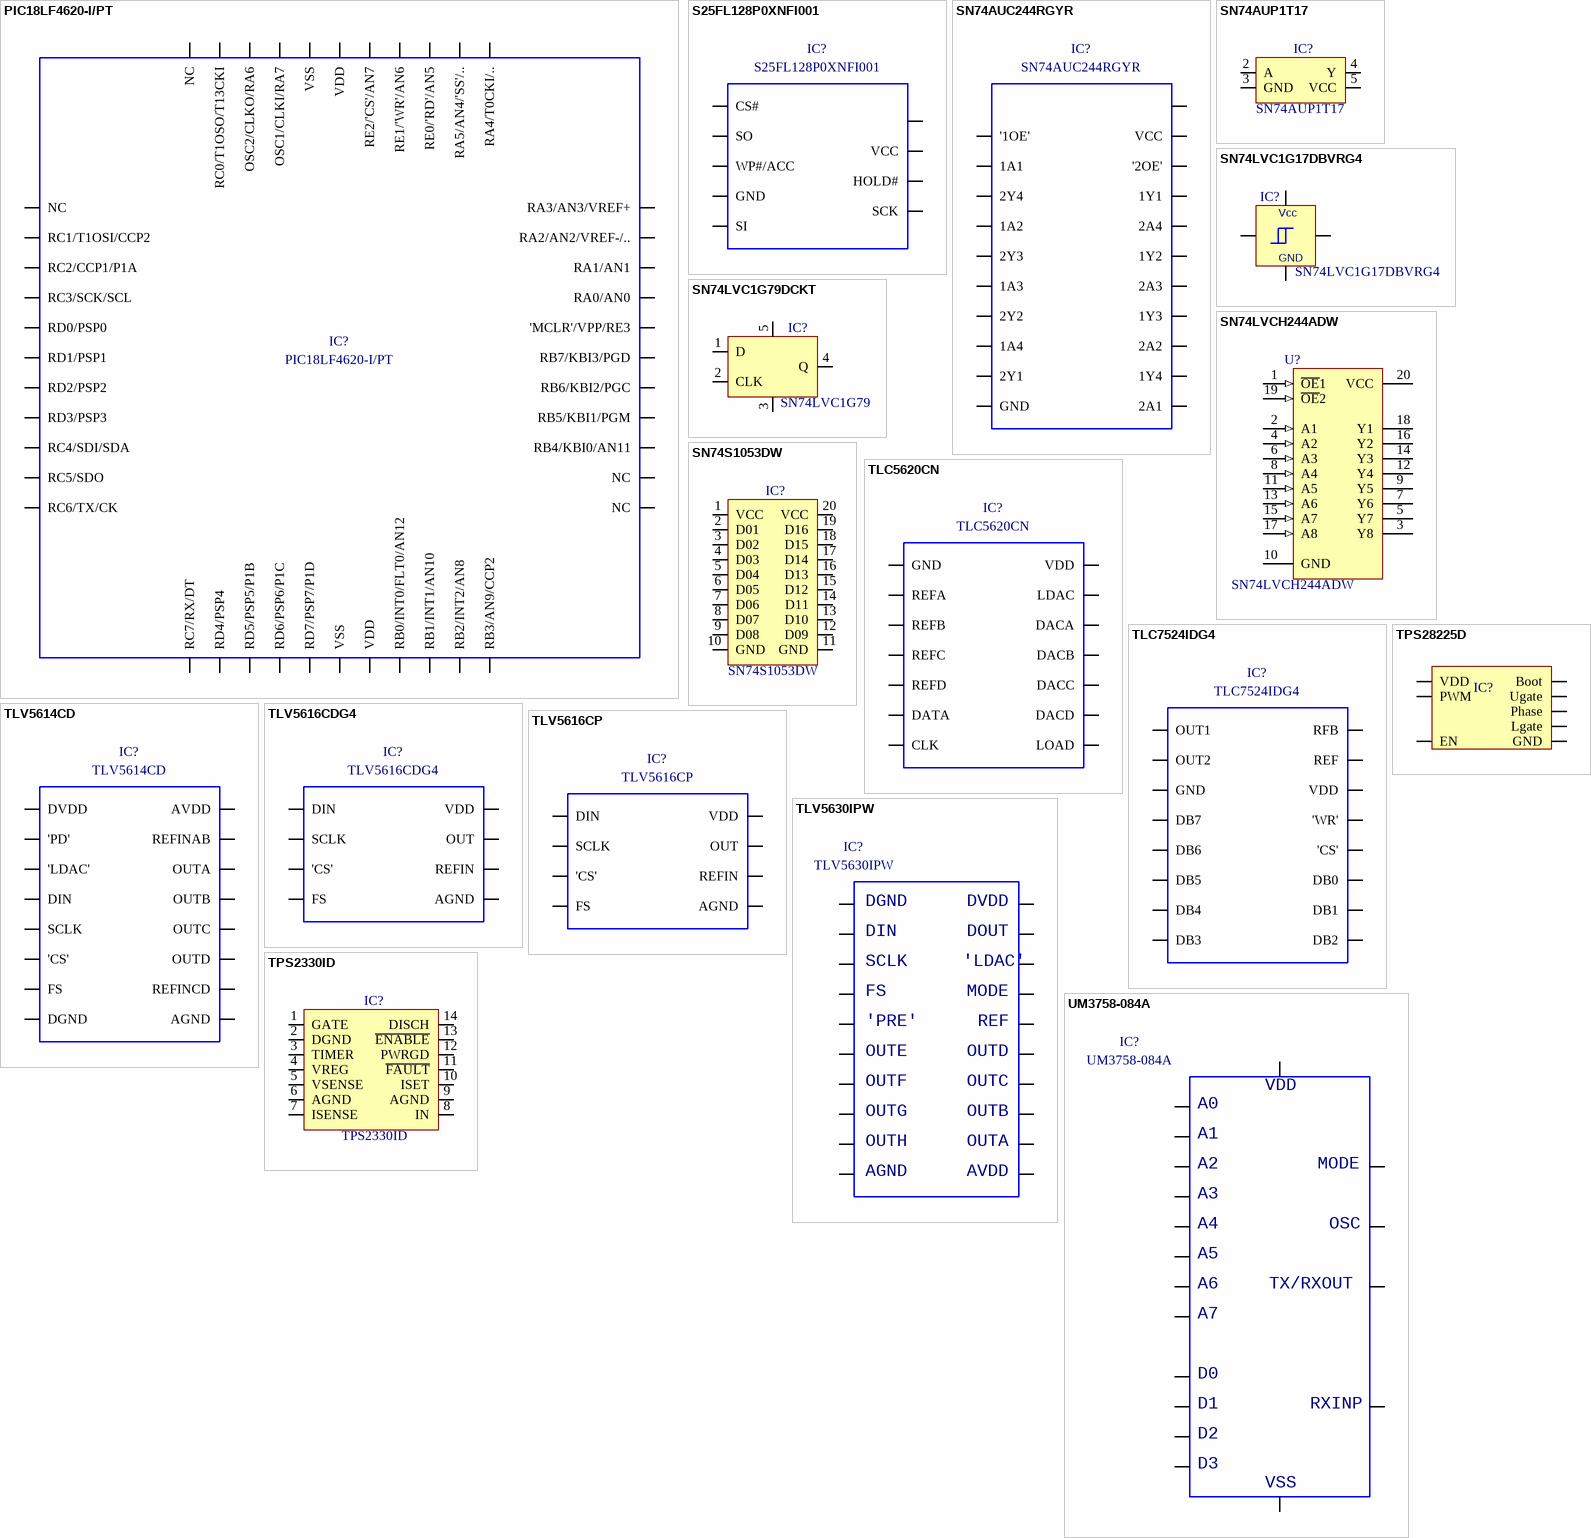
[diagram p171: symbols PIC18LF4620-I/PT to UM3758-084A]

## PIC18LF4620-I/PT
designator IC?
enhanced flash microcontrollers with 10-Bit A/D
footprint smd TQFP/44
pins: 1 RC7/RX/DT, 2 RD4/PSP4, 3 RD5/PSP5/P1B, 4 RD6/PSP6/P1C, 5 RD7/PSP7/P1D, 6 VSS, 7 VDD, 8 RB0/INT0/FLT0/AN12, 9 RB1/INT1/AN10, 10 RB2/INT2/AN8, 11 RB3/AN9/CCP2, 12 NC, 13 NC, 14 RB4/KBI0/AN11, 15 RB5/KBI1/PGM, 16 RB6/KBI2/PGC, 17 RB7/KBI3/PGD, 18 'MCLR'/VPP/RE3, 19 RA0/AN0, 20 RA1/AN1, 21 RA2/AN2/VREF-/.., 22 RA3/AN3/VREF+, 23 RA4/T0CKI/.., 24 RA5/AN4/'SS'/.., 25 RE0/'RD'/AN5, 26 RE1/'WR'/AN6, 27 RE2/'CS'/AN7, 28 VDD, 29 VSS, 30 OSC1/CLKI/RA7, 31 OSC2/CLKO/RA6, 32 RC0/T1OSO/T13CKI, 33 NC, 34 NC, 35 RC1/T1OSI/CCP2, 36 RC2/CCP1/P1A, 37 RC3/SCK/SCL, 38 RD0/PSP0, 39 RD1/PSP1, 40 RD2/PSP2, 41 RD3/PSP3, 42 RC4/SDI/SDA, 43 RC5/SDO, 44 RC6/TX/CK

## S25FL128P0XNFI001
designator IC?
128 Megabit CMOS 3.0 Volt Flash Memory
footprint smd WSON/8 (6x8mm)
pins: 1 CS#, 2 SO, 3 WP#/ACC, 4 GND, 5 SI, 6 SCK, 7 HOLD#, 8 VCC, 9

## SN74AUC244RGYR
designator IC?
octal buffer/driver with 3-state outputs
footprint smd QFN/20 (4.5x3.5mm pitch 0.5)
pins: 1 '1OE', 2 1A1, 3 2Y4, 4 1A2, 5 2Y3, 6 1A3, 7 2Y2, 8 1A4, 9 2Y1, 10 GND, 11 2A1, 12 1Y4, 13 2A2, 14 1Y3, 15 2A3, 16 1Y2, 17 2A4, 18 1Y1, 19 '2OE', 20 VCC, 21

## SN74AUP1T17
designator IC?
LOW POWER, 1.8/2.5/3.3-V INPUT, 3.3-V CMOS OUTPUT, SINGLE  SCHMITT-TRIGGER BUFFER GATE
footprint smd SC-70
pins: 2 A, 3 GND, 4 Y, 5 VCC

## SN74LVC1G17DBVRG4
designator IC?
Single Schmitt-trigger buffer
footprint smd SOT-23/5p (body 1.6 wide, pitch 0.95mm)
pins: 2 A, 3 GND, 4 Y, 5 VCC
text: Vcc

## SN74LVC1G79DCKT
designator IC?, comment SN74LVC1G79
SINGLE POSITIVE-EDGE-TRIGGERED D-TYPE FLIP-FLOP
footprint smd sc-70
pins: 1 D, 2 CLK, 3, 4 Q, 5

## SN74LVCH244ADW
designator U?
Octal Buffer/Driver with 3-State Outputs; Published: 8-Jun-2000; LatestRevisionDate: 13-Apr-2006; LatestRevisionNote: IPC-7351 Footprint Added.; DatasheetVersion: Jul-1995; PackageVersion: Mar-2000; PackageReference: DW020; Publisher: Altium Limited; PackageDescription: 20-Pin Plastic Small Outline Integrated Circuit 1.27 mm Pitch; Code_JEDEC: MS-013; Code_IPC: SOIC127P1030-20; ComponentLink1Description: Manufacturer Link; ComponentLink1URL: http://www.ti.com/; ComponentLink2Description: Datasheet; ComponentLink2URL: http://www-s.ti.com/sc/ds/sn74lvch244a.pdf
footprint smd SOICN/20 (SOIC, 20-Leads, Body 12.8x7.5mm, Pitch 1.27mm, IPC Medium Density)
pins: 1 ~{OE}1 (in), 2 A1 (in), 3 Y8 (hiz), 4 A2 (in), 5 Y7 (hiz), 6 A3 (in), 7 Y6 (hiz), 8 A4 (in), 9 Y5 (hiz), 10 GND (power), 11 A5 (in), 12 Y4 (hiz), 13 A6 (in), 14 Y3 (hiz), 15 A7 (in), 16 Y2 (hiz), 17 A8 (in), 18 Y1 (hiz), 19 ~{OE}2 (in), 20 VCC (power)

## SN74S1053DW
designator IC?
16-BIT SCHOTTKY BARRIER DIODE
footprint smd soicn/20 (SOIC, 20-Leads, Body 12.8x7.5mm, Pitch 1.27mm, IPC Medium Density)
pins: 1 VCC, 2 D01, 3 D02, 4 D03, 5 D04, 6 D05, 7 D06, 8 D07, 9 D08, 10 GND, 11 GND, 12 D09, 13 D10, 14 D11, 15 D12, 16 D13, 17 D14, 18 D15, 19 D16, 20 VCC

## TLC5620CN
designator IC?
quadruple 8-bit DAC
footprint icv DIP14-300
pins: 1 GND, 2 REFA, 3 REFB, 4 REFC, 5 REFD, 6 DATA, 7 CLK, 8 LOAD, 9 DACD, 10 DACC, 11 DACB, 12 DACA, 13 LDAC, 14 VDD

## TLC7524IDG4
designator IC?
8-bit multiplying DAC
footprint smd SOICN/16
pins: 1 OUT1, 2 OUT2, 3 GND, 4 DB7, 5 DB6, 6 DB5, 7 DB4, 8 DB3, 9 DB2, 10 DB1, 11 DB0, 12 'CS', 13 'WR', 14 VDD, 15 REF, 16 RFB

## TLV5614CD
designator IC?
2.7V tot 5.5V 12-bit quadruple DAC with power down
footprint smd SOICN/16
pins: 1 DVDD, 2 'PD', 3 'LDAC', 4 DIN, 5 SCLK, 6 'CS', 7 FS, 8 DGND, 9 AGND, 10 REFINCD, 11 OUTD, 12 OUTC, 13 OUTB, 14 OUTA, 15 REFINAB, 16 AVDD

## TLV5616CDG4
designator IC?
2.7V tot 5.5V low power 12-bit DAC with power down
footprint smd SOICN/8
pins: 1 DIN, 2 SCLK, 3 'CS', 4 FS, 5 AGND, 6 REFIN, 7 OUT, 8 VDD

## TLV5616CP
designator IC?
2.7V to 5.5V low power D/A convertor with power down
footprint icv DIP8-300
pins: 1 DIN, 2 SCLK, 3 'CS', 4 FS, 5 AGND, 6 REFIN, 7 OUT, 8 VDD

## TLV5630IPW
designator IC?
low power 12-bit D/A converter
footprint smd TSSOP/20 (body 4.4 pitch 0.65)
pins: 1, 2, 3, 4, 5, 6, 7, 8, 9, 10, 11, 12, 13, 14, 15, 16, 17, 18, 19, 20
text: DGND; DVDD; DIN; DOUT; SCLK; 'LDAC'; FS; MODE; 'PRE'; REF; OUTE; OUTD; OUTF; OUTC; OUTG; OUTB; OUTH; OUTA; AGND; AVDD

## TPS2330ID
designator IC?
SINGLE HOT-SWAP POWER CONTROLLERS WITH  CIRCUIT BREAKER AND POWER-GOOD REPORTING
footprint smd soicn/14
pins: 1 GATE, 2 DGND, 3 TIMER, 4 VREG, 5 VSENSE, 6 AGND, 7 ISENSE, 8 IN, 9 AGND, 10 ISET, 11 ~{FAULT}, 12 PWRGD, 13 ~{ENABLE}, 14 DISCH

## TPS28225D
designator IC?  (value not drawn)
High-Frequency 4-A Sink Synchronous MOSFET Driver
footprint smd SOICN/8
pins: 1 Ugate, 2 Boot, 3 PWM, 4 GND, 5 Lgate, 6 VDD, 7 EN, 8 Phase

## UM3758-084A
designator IC?
3-state programmeerbare encoder/decoder
footprint icv DIP18-300
pins: 1, 2, 3, 4, 5, 6, 7, 8, 9, 10, 11, 12, 13, 14, 15, 16, 17, 18 (power)
text: VDD; A0; A1; A2; MODE; A3; A4; OSC; A5; A6; TX/RXOUT; A7; D0; D1; RXINP; D2; D3; VSS

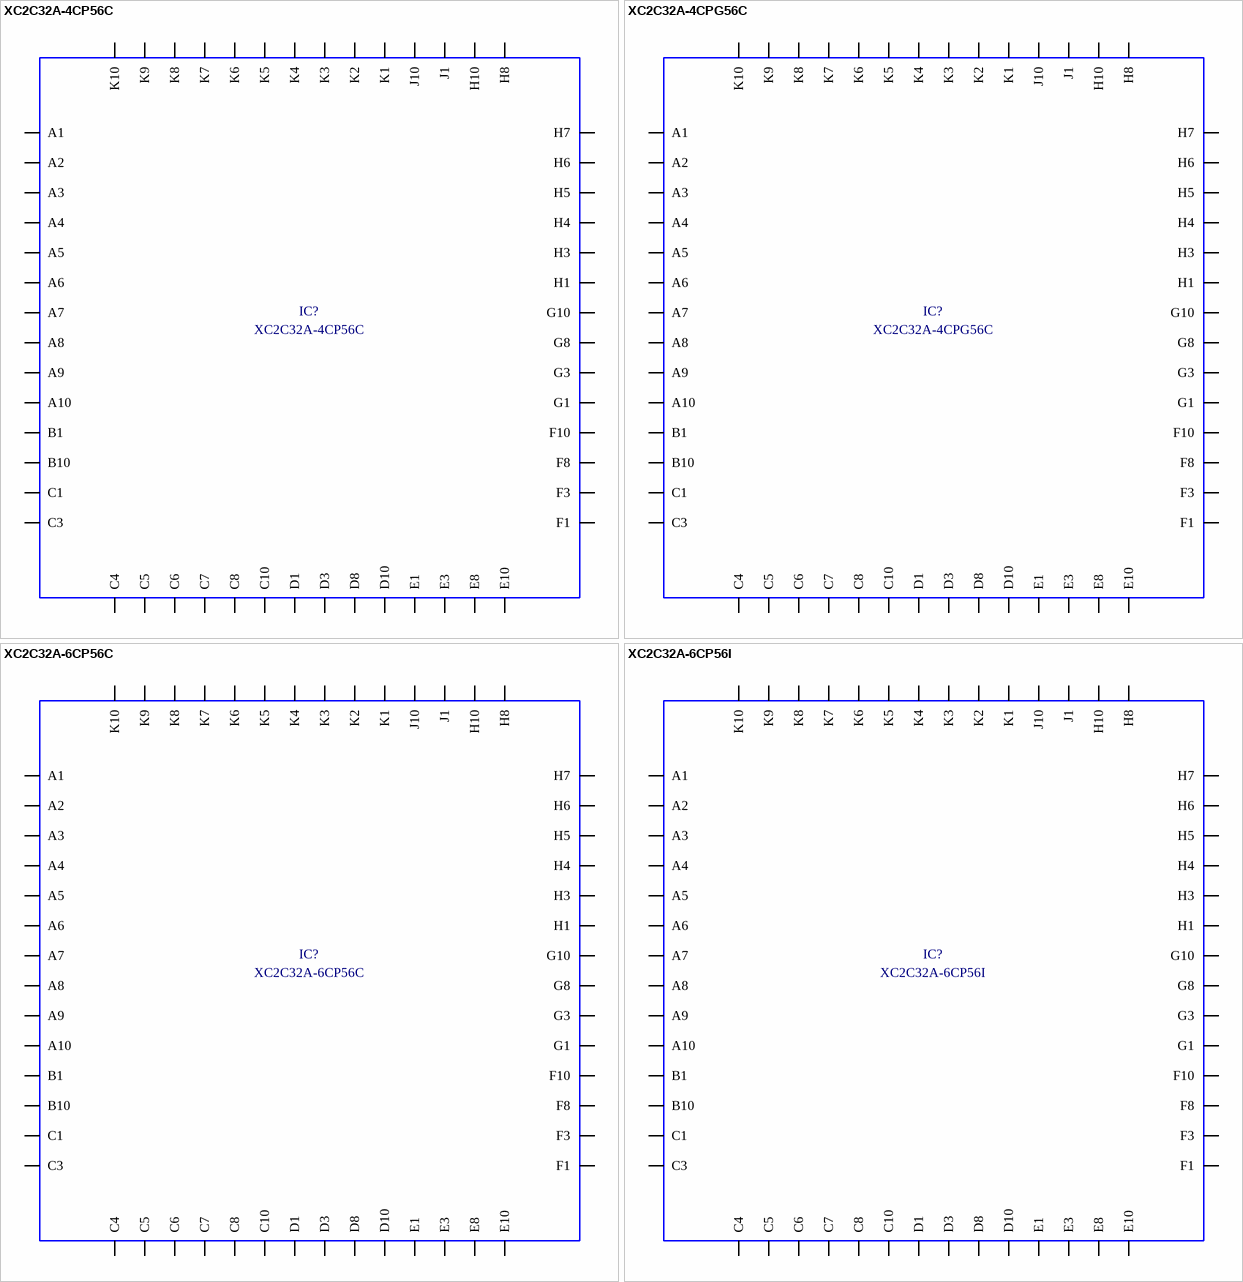
[diagram p172: symbols XC2C32A-4CP56C to XC2C32A-6CP56I]

## XC2C32A-4CP56C
designator IC?
XC2C32A CoolRunner-II CPLD
footprint smd CSBGA56 (Xilinx)
pins: 1 A1, 2 A2, 3 A3, 4 A4, 5 A5, 6 A6, 7 A7, 8 A8, 9 A9, 10 A10, 11 B1, 12 B10, 13 C1, 14 C3, 15 C4, 16 C5, 17 C6, 18 C7, 19 C8, 20 C10, 21 D1, 22 D3, 23 D8, 24 D10, 25 E1, 26 E3, 27 E8, 28 E10, 29 F1, 30 F3, 31 F8, 32 F10, 33 G1, 34 G3, 35 G8, 36 G10, 37 H1, 38 H3, 39 H4, 40 H5, 41 H6, 42 H7, 43 H8, 44 H10, 45 J1, 46 J10, 47 K1, 48 K2, 49 K3, 50 K4, 51 K5, 52 K6, 53 K7, 54 K8, 55 K9, 56 K10

## XC2C32A-4CPG56C
designator IC?
XC2C32A CoolRunner-II CPLD; Part Number: XC2C32A-4CPG56C; Component Kind: Standard; Component Type: Standard; Designator: XC2C32A-4CPG56C; Footprint: smd CSBGA56 (Xilinx); Library Reference: XC2C32A-4CPG56C; Pin Count: 56
footprint smd CSBGA56 (Xilinx)
pins: 1 A1, 2 A2, 3 A3, 4 A4, 5 A5, 6 A6, 7 A7, 8 A8, 9 A9, 10 A10, 11 B1, 12 B10, 13 C1, 14 C3, 15 C4, 16 C5, 17 C6, 18 C7, 19 C8, 20 C10, 21 D1, 22 D3, 23 D8, 24 D10, 25 E1, 26 E3, 27 E8, 28 E10, 29 F1, 30 F3, 31 F8, 32 F10, 33 G1, 34 G3, 35 G8, 36 G10, 37 H1, 38 H3, 39 H4, 40 H5, 41 H6, 42 H7, 43 H8, 44 H10, 45 J1, 46 J10, 47 K1, 48 K2, 49 K3, 50 K4, 51 K5, 52 K6, 53 K7, 54 K8, 55 K9, 56 K10

## XC2C32A-6CP56C
designator IC?
XC2C32A CoolRunner-II CPLD; Part Number: XC2C32A-6CP56C; Component Kind: Standard; Component Type: Standard; Designator: XC2C32A-6CP56C; Footprint: smd CSBGA56 (Xilinx); Library Reference: XC2C32A-6CP56C; Pin Count: 56
footprint smd CSBGA56 (Xilinx)
pins: 1 A1, 2 A2, 3 A3, 4 A4, 5 A5, 6 A6, 7 A7, 8 A8, 9 A9, 10 A10, 11 B1, 12 B10, 13 C1, 14 C3, 15 C4, 16 C5, 17 C6, 18 C7, 19 C8, 20 C10, 21 D1, 22 D3, 23 D8, 24 D10, 25 E1, 26 E3, 27 E8, 28 E10, 29 F1, 30 F3, 31 F8, 32 F10, 33 G1, 34 G3, 35 G8, 36 G10, 37 H1, 38 H3, 39 H4, 40 H5, 41 H6, 42 H7, 43 H8, 44 H10, 45 J1, 46 J10, 47 K1, 48 K2, 49 K3, 50 K4, 51 K5, 52 K6, 53 K7, 54 K8, 55 K9, 56 K10

## XC2C32A-6CP56I
designator IC?
XC2C32A CoolRunner-II CPLD; Part Number: XC2C32A-6CP56I; Component Kind: Standard; Component Type: Standard; Designator: XC2C32A-6CP56I; Footprint: smd CSBGA56 (Xilinx); Library Reference: XC2C32A-6CP56I; Pin Count: 56
footprint smd CSBGA56 (Xilinx)
pins: 1 A1, 2 A2, 3 A3, 4 A4, 5 A5, 6 A6, 7 A7, 8 A8, 9 A9, 10 A10, 11 B1, 12 B10, 13 C1, 14 C3, 15 C4, 16 C5, 17 C6, 18 C7, 19 C8, 20 C10, 21 D1, 22 D3, 23 D8, 24 D10, 25 E1, 26 E3, 27 E8, 28 E10, 29 F1, 30 F3, 31 F8, 32 F10, 33 G1, 34 G3, 35 G8, 36 G10, 37 H1, 38 H3, 39 H4, 40 H5, 41 H6, 42 H7, 43 H8, 44 H10, 45 J1, 46 J10, 47 K1, 48 K2, 49 K3, 50 K4, 51 K5, 52 K6, 53 K7, 54 K8, 55 K9, 56 K10

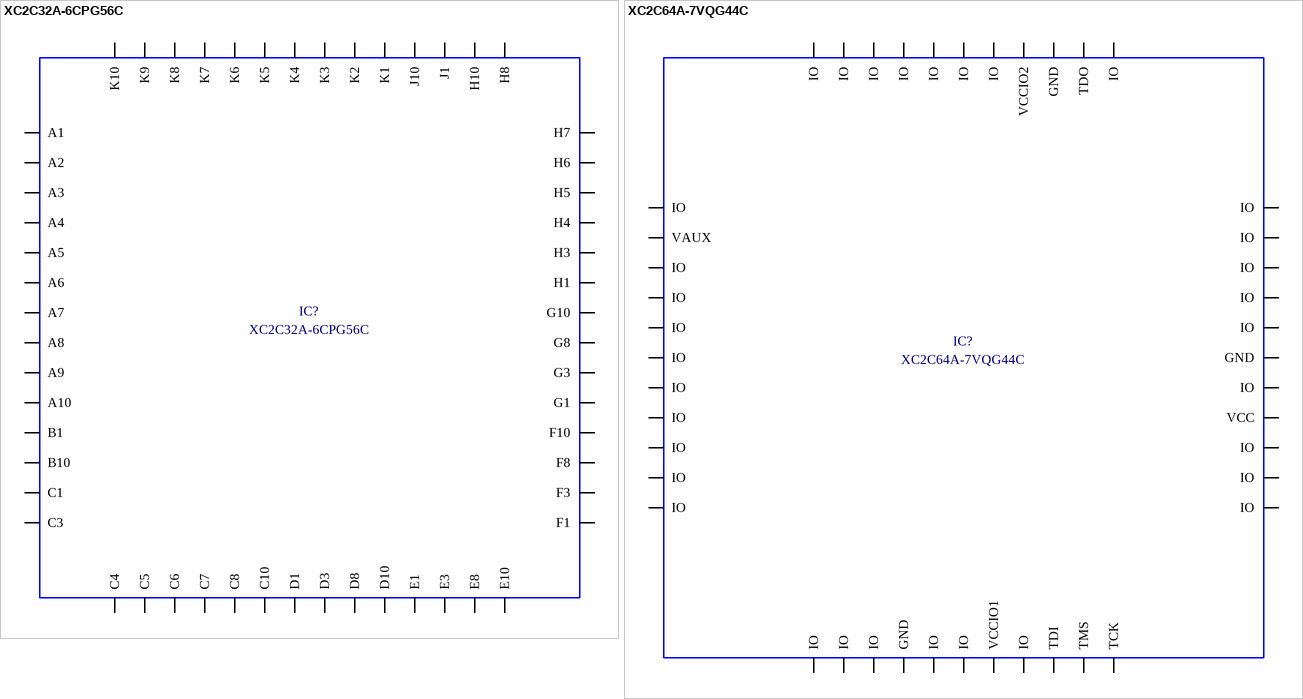
[diagram p173: symbols XC2C32A-6CPG56C to XC2C64A-7VQG44C]

## XC2C32A-6CPG56C
designator IC?
XC2C32A CoolRunner-II CPLD; Part Number: XC2C32A-6CPG56C; Component Kind: Standard; Component Type: Standard; Designator: XC2C32A-6CPG56C; Footprint: smd CSBGA56 (Xilinx); Library Reference: XC2C32A-6CPG56C; Pin Count: 56
footprint smd CSBGA56 (Xilinx)
pins: 1 A1, 2 A2, 3 A3, 4 A4, 5 A5, 6 A6, 7 A7, 8 A8, 9 A9, 10 A10, 11 B1, 12 B10, 13 C1, 14 C3, 15 C4, 16 C5, 17 C6, 18 C7, 19 C8, 20 C10, 21 D1, 22 D3, 23 D8, 24 D10, 25 E1, 26 E3, 27 E8, 28 E10, 29 F1, 30 F3, 31 F8, 32 F10, 33 G1, 34 G3, 35 G8, 36 G10, 37 H1, 38 H3, 39 H4, 40 H5, 41 H6, 42 H7, 43 H8, 44 H10, 45 J1, 46 J10, 47 K1, 48 K2, 49 K3, 50 K4, 51 K5, 52 K6, 53 K7, 54 K8, 55 K9, 56 K10

## XC2C64A-7VQG44C
designator IC?
CPLD
footprint smd TQFP/44
pins: 1 IO, 2 IO, 3 IO, 4 GND, 5 IO, 6 IO, 7 VCCIO1, 8 IO, 9 TDI, 10 TMS, 11 TCK, 12 IO, 13 IO, 14 IO, 15 VCC, 16 IO, 17 GND, 18 IO, 19 IO, 20 IO, 21 IO, 22 IO, 23 IO, 24 TDO, 25 GND, 26 VCCIO2, 27 IO, 28 IO, 29 IO, 30 IO, 31 IO, 32 IO, 33 IO, 34 IO, 35 VAUX, 36 IO, 37 IO, 38 IO, 39 IO, 40 IO, 41 IO, 42 IO, 43 IO, 44 IO

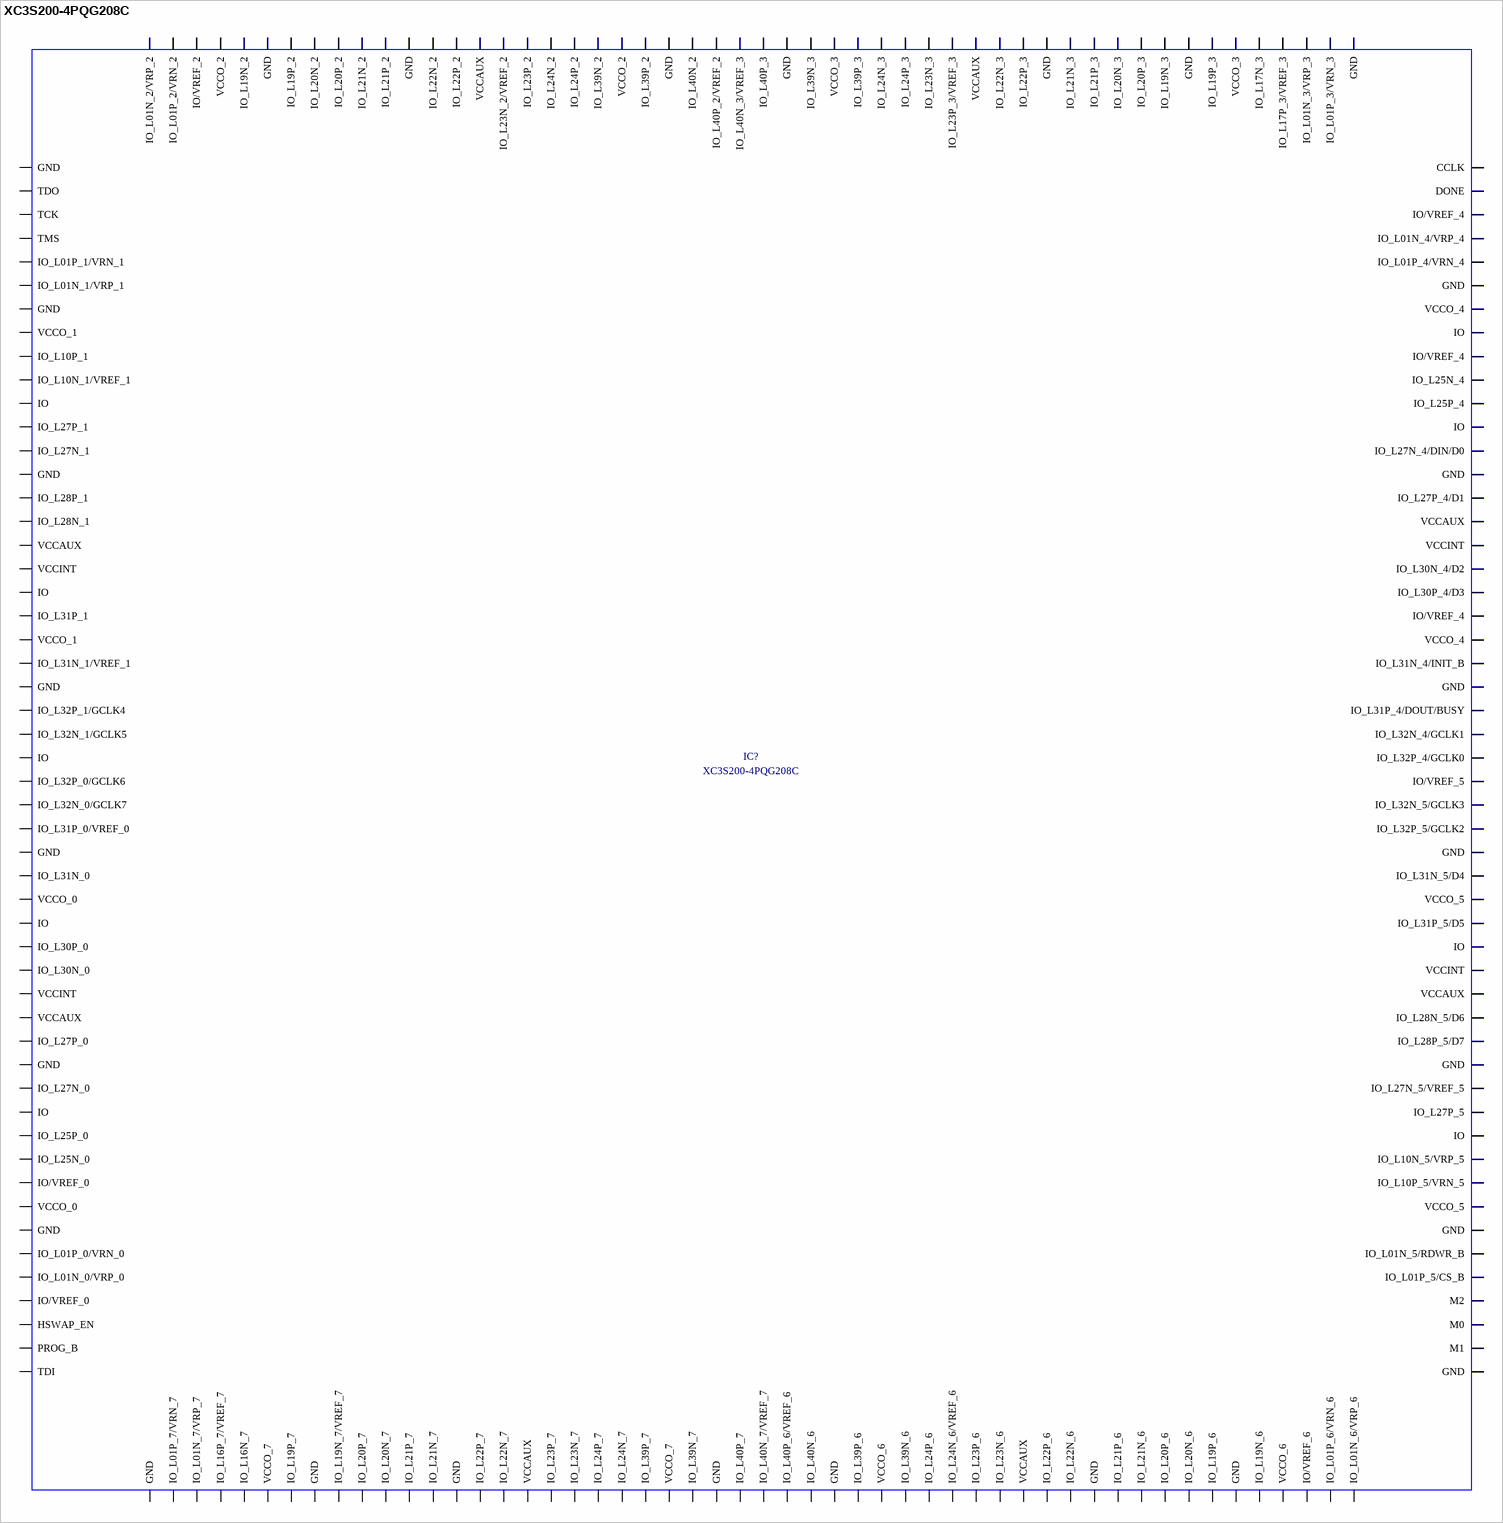
[diagram p174: symbol XC3S200-4PQG208C]